# Altium schematic symbol library 74xx-eu.SCHLIB: 627 symbols (part 1 of 4)
Pins are listed as number, name and electrical type; pins without a type are passive.

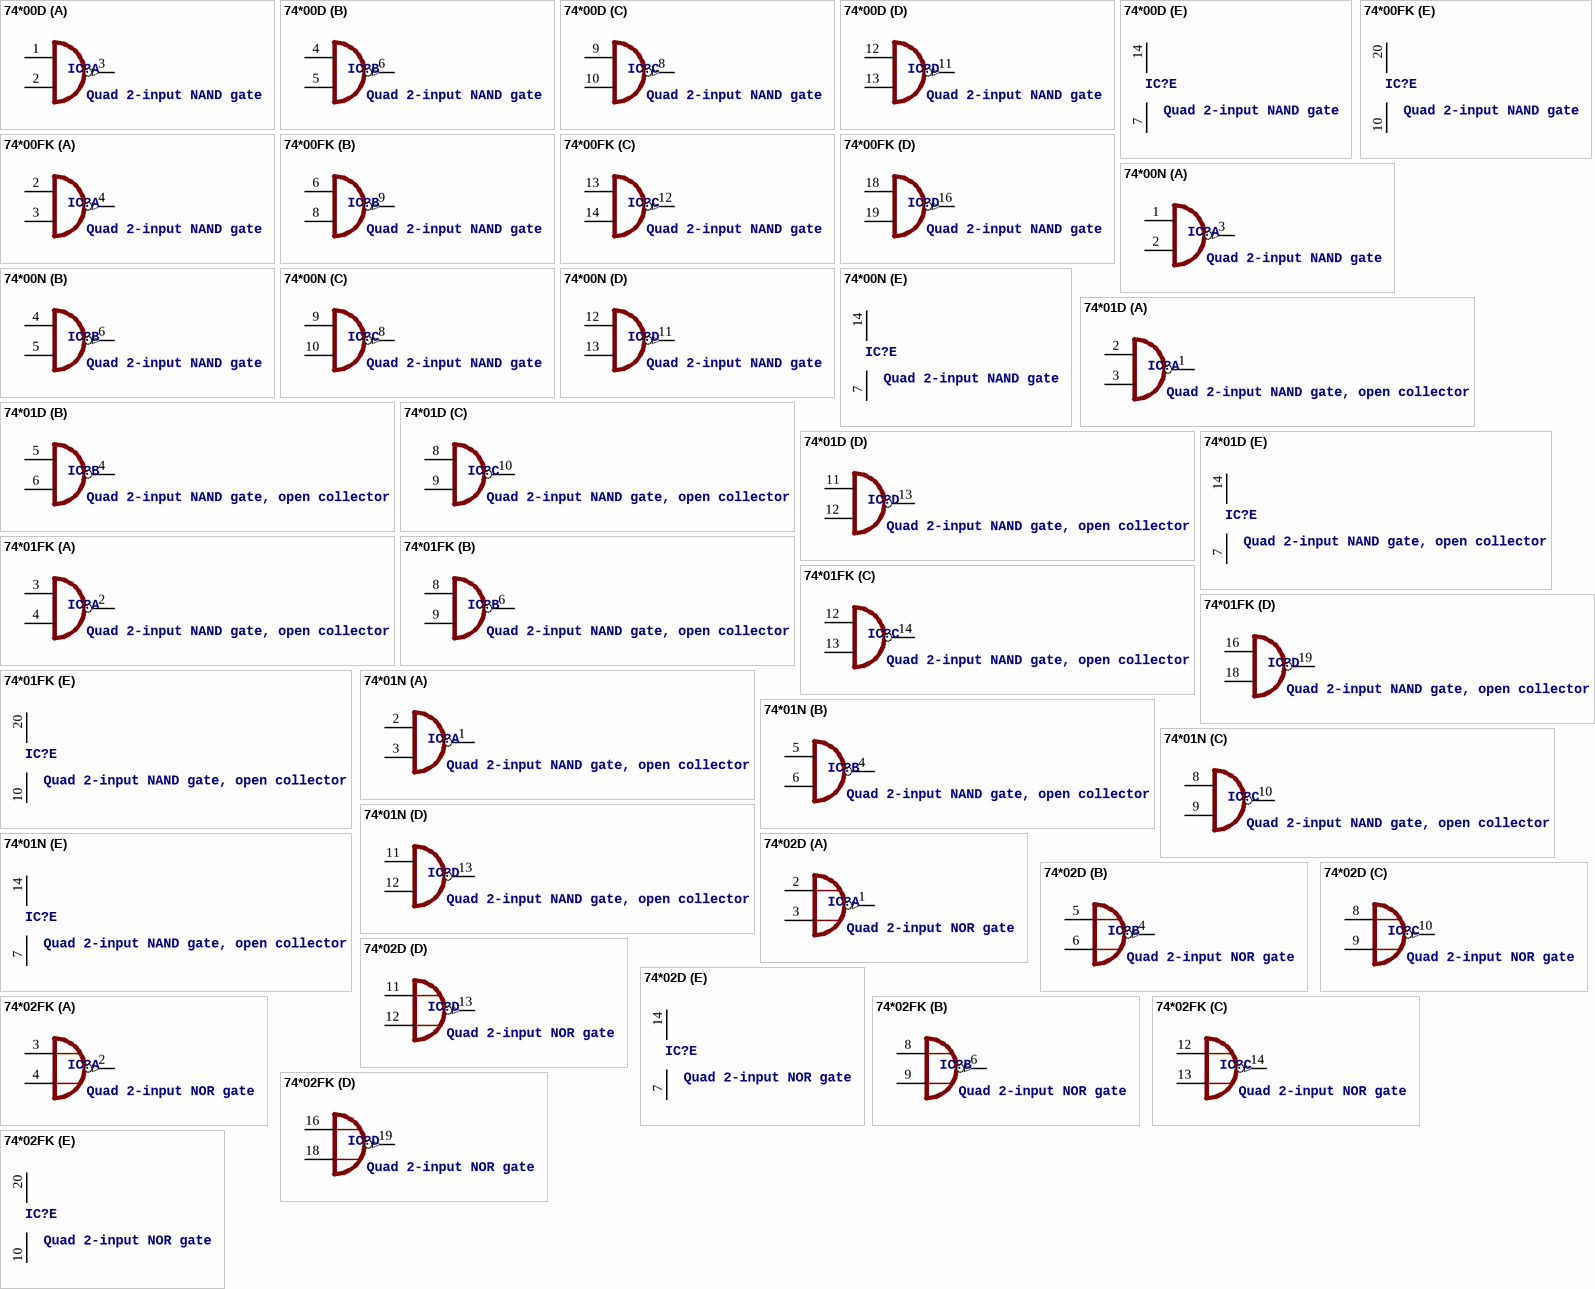
[diagram p0: symbols 74*00D to 74*02FK]

## 74*00D
designator IC?, comment Quad 2-input NAND gate
footprint SO14
part A pins: 1 I0, 2 I1, 3 O (out)
part B pins: 4 I0, 5 I1, 6 O (out)
part C pins: 8 O (out), 9 I0, 10 I1
part D pins: 11 O (out), 12 I0, 13 I1
part E pins: 7 GND (power), 14 VCC (power)

## 74*00FK
designator IC?, comment Quad 2-input NAND gate
footprint LCC20
part A pins: 2 I0, 3 I1, 4 O (out)
part B pins: 6 I0, 8 I1, 9 O (out)
part C pins: 12 O (out), 13 I0, 14 I1
part D pins: 16 O (out), 18 I0, 19 I1
part E pins: 10 GND (power), 20 VCC (power)

## 74*00N
designator IC?, comment Quad 2-input NAND gate
footprint DIL14
part A pins: 1 I0, 2 I1, 3 O (out)
part B pins: 4 I0, 5 I1, 6 O (out)
part C pins: 8 O (out), 9 I0, 10 I1
part D pins: 11 O (out), 12 I0, 13 I1
part E pins: 7 GND (power), 14 VCC (power)

## 74*01D
designator IC?, comment Quad 2-input NAND gate, open collector
footprint SO14
part A pins: 1 O (oc), 2 I0, 3 I1
part B pins: 4 O (oc), 5 I0, 6 I1
part C pins: 8 I0, 9 I1, 10 O (oc)
part D pins: 11 I0, 12 I1, 13 O (oc)
part E pins: 7 GND (power), 14 VCC (power)

## 74*01FK
designator IC?, comment Quad 2-input NAND gate, open collector
footprint LCC20
part A pins: 2 O (oc), 3 I0, 4 I1
part B pins: 6 O (oc), 8 I0, 9 I1
part C pins: 12 I0, 13 I1, 14 O (oc)
part D pins: 16 I0, 18 I1, 19 O (oc)
part E pins: 10 GND (power), 20 VCC (power)

## 74*01N
designator IC?, comment Quad 2-input NAND gate, open collector
footprint DIL14
part A pins: 1 O (oc), 2 I0, 3 I1
part B pins: 4 O (oc), 5 I0, 6 I1
part C pins: 8 I0, 9 I1, 10 O (oc)
part D pins: 11 I0, 12 I1, 13 O (oc)
part E pins: 7 GND (power), 14 VCC (power)

## 74*02D
designator IC?, comment Quad 2-input NOR gate
footprint SO14
part A pins: 1 O (out), 2 I0, 3 I1
part B pins: 4 O (out), 5 I0, 6 I1
part C pins: 8 I0, 9 I1, 10 O (out)
part D pins: 11 I0, 12 I1, 13 O (out)
part E pins: 7 GND (power), 14 VCC (power)

## 74*02FK
designator IC?, comment Quad 2-input NOR gate
footprint LCC20
part A pins: 2 O (out), 3 I0, 4 I1
part B pins: 6 O (out), 8 I0, 9 I1
part C pins: 12 I0, 13 I1, 14 O (out)
part D pins: 16 I0, 18 I1, 19 O (out)
part E pins: 10 GND (power), 20 VCC (power)

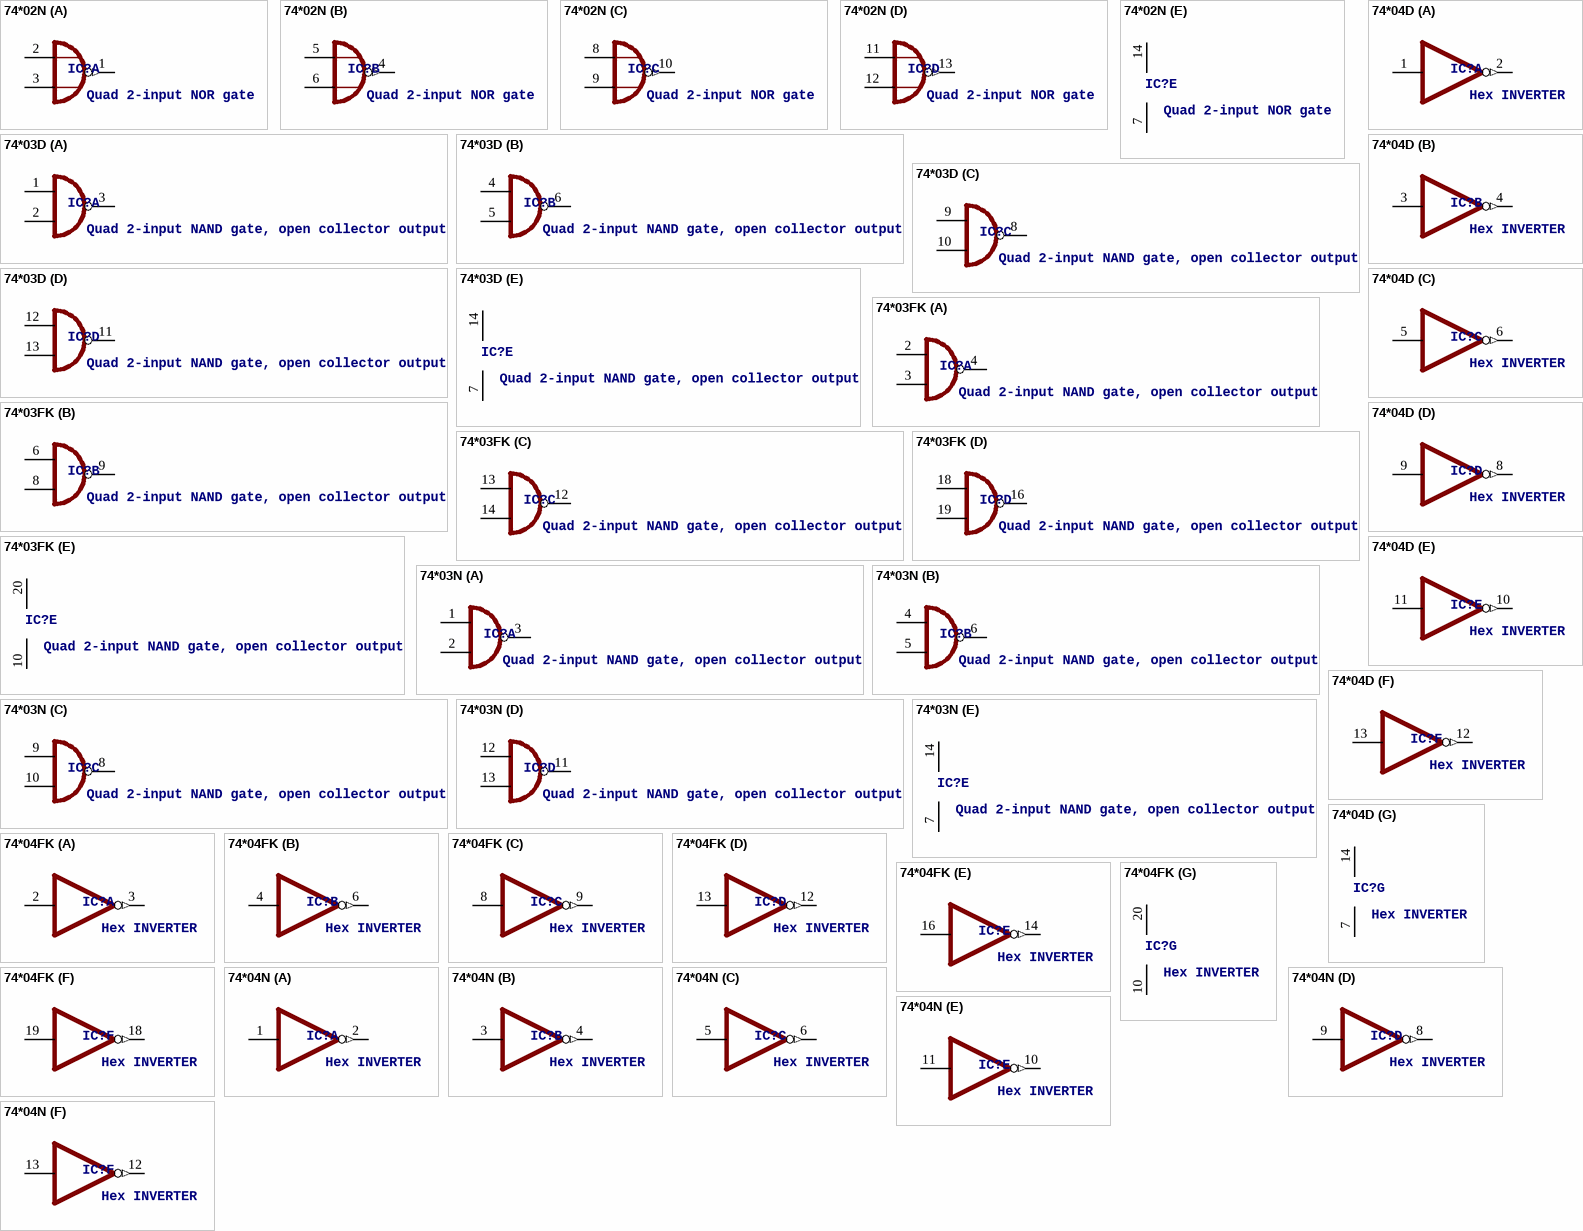
[diagram p1: symbols 74*02N to 74*04N]

## 74*02N
designator IC?, comment Quad 2-input NOR gate
footprint DIL14
part A pins: 1 O (out), 2 I0, 3 I1
part B pins: 4 O (out), 5 I0, 6 I1
part C pins: 8 I0, 9 I1, 10 O (out)
part D pins: 11 I0, 12 I1, 13 O (out)
part E pins: 7 GND (power), 14 VCC (power)

## 74*03D
designator IC?, comment Quad 2-input NAND gate, open collector output
footprint SO14
part A pins: 1 I0, 2 I1, 3 O (oc)
part B pins: 4 I0, 5 I1, 6 O (oc)
part C pins: 8 O (oc), 9 I0, 10 I1
part D pins: 11 O (oc), 12 I0, 13 I1
part E pins: 7 GND (power), 14 VCC (power)

## 74*03FK
designator IC?, comment Quad 2-input NAND gate, open collector output
footprint LCC20
part A pins: 2 I0, 3 I1, 4 O (oc)
part B pins: 6 I0, 8 I1, 9 O (oc)
part C pins: 12 O (oc), 13 I0, 14 I1
part D pins: 16 O (oc), 18 I0, 19 I1
part E pins: 10 GND (power), 20 VCC (power)

## 74*03N
designator IC?, comment Quad 2-input NAND gate, open collector output
footprint DIL14
part A pins: 1 I0, 2 I1, 3 O (oc)
part B pins: 4 I0, 5 I1, 6 O (oc)
part C pins: 8 O (oc), 9 I0, 10 I1
part D pins: 11 O (oc), 12 I0, 13 I1
part E pins: 7 GND (power), 14 VCC (power)

## 74*04D
designator IC?, comment Hex INVERTER
footprint SO14
part A pins: 1 I, 2 O (out)
part B pins: 3 I, 4 O (out)
part C pins: 5 I, 6 O (out)
part D pins: 8 O (out), 9 I
part E pins: 10 O (out), 11 I
part F pins: 12 O (out), 13 I
part G pins: 7 GND (power), 14 VCC (power)

## 74*04FK
designator IC?, comment Hex INVERTER
footprint LCC20
part A pins: 2 I, 3 O (out)
part B pins: 4 I, 6 O (out)
part C pins: 8 I, 9 O (out)
part D pins: 12 O (out), 13 I
part E pins: 14 O (out), 16 I
part F pins: 18 O (out), 19 I
part G pins: 10 GND (power), 20 VCC (power)

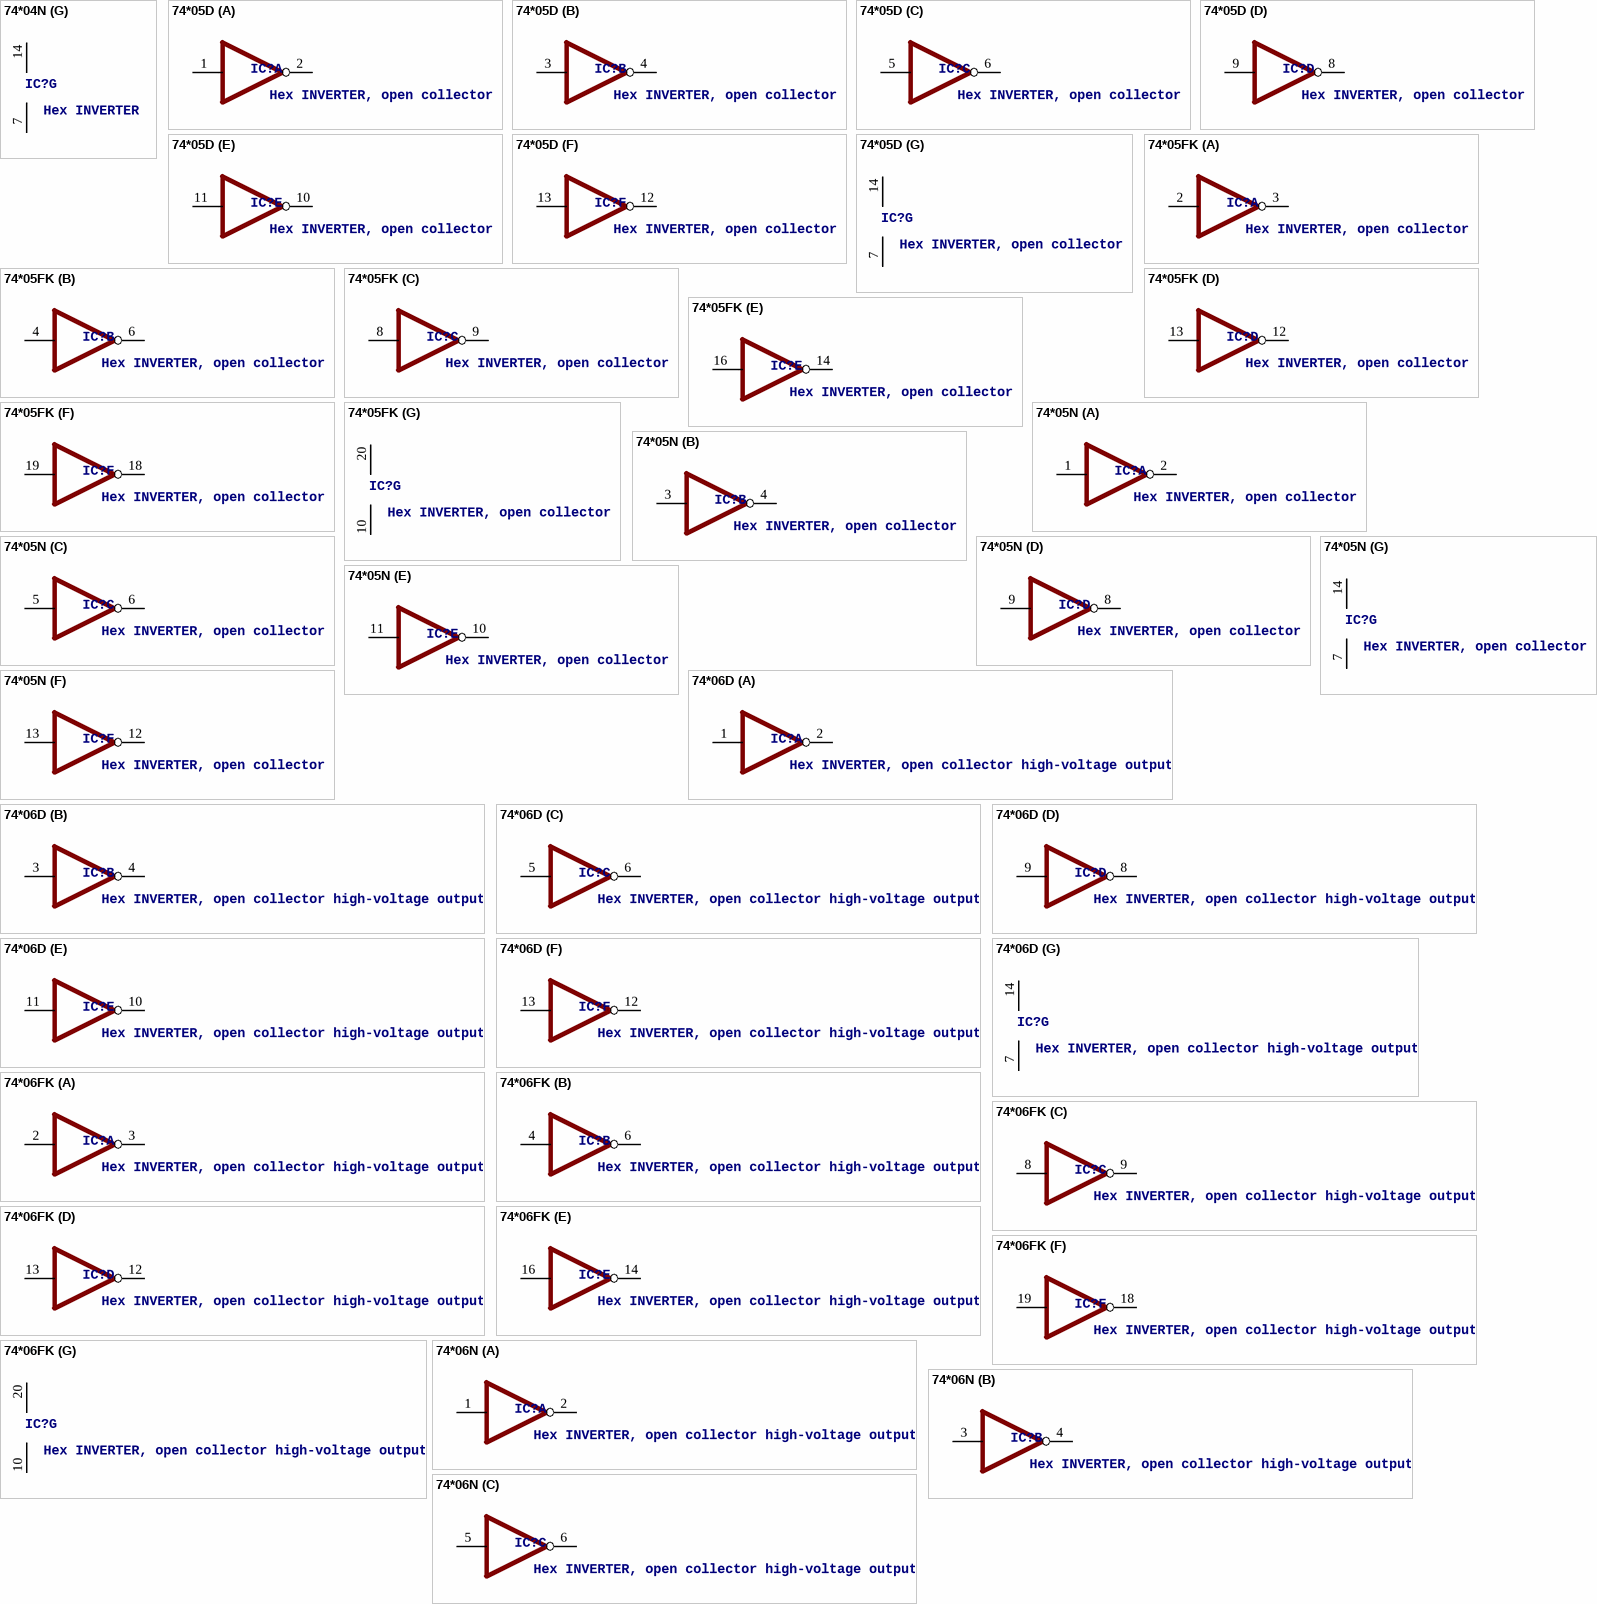
[diagram p2: symbols 74*04N to 74*06N]

## 74*04N
designator IC?, comment Hex INVERTER
footprint DIL14
part A pins: 1 I, 2 O (out)
part B pins: 3 I, 4 O (out)
part C pins: 5 I, 6 O (out)
part D pins: 8 O (out), 9 I
part E pins: 10 O (out), 11 I
part F pins: 12 O (out), 13 I
part G pins: 7 GND (power), 14 VCC (power)

## 74*05D
designator IC?, comment Hex INVERTER, open collector
footprint SO14
part A pins: 1 I, 2 O (oc)
part B pins: 3 I, 4 O (oc)
part C pins: 5 I, 6 O (oc)
part D pins: 8 O (oc), 9 I
part E pins: 10 O (oc), 11 I
part F pins: 12 O (oc), 13 I
part G pins: 7 GND (power), 14 VCC (power)

## 74*05FK
designator IC?, comment Hex INVERTER, open collector
footprint LCC20
part A pins: 2 I, 3 O (oc)
part B pins: 4 I, 6 O (oc)
part C pins: 8 I, 9 O (oc)
part D pins: 12 O (oc), 13 I
part E pins: 14 O (oc), 16 I
part F pins: 18 O (oc), 19 I
part G pins: 10 GND (power), 20 VCC (power)

## 74*05N
designator IC?, comment Hex INVERTER, open collector
footprint DIL14
part A pins: 1 I, 2 O (oc)
part B pins: 3 I, 4 O (oc)
part C pins: 5 I, 6 O (oc)
part D pins: 8 O (oc), 9 I
part E pins: 10 O (oc), 11 I
part F pins: 12 O (oc), 13 I
part G pins: 7 GND (power), 14 VCC (power)

## 74*06D
designator IC?, comment Hex INVERTER, open collector high-voltage output
footprint SO14
part A pins: 1 I, 2 O (oc)
part B pins: 3 I, 4 O (oc)
part C pins: 5 I, 6 O (oc)
part D pins: 8 O (oc), 9 I
part E pins: 10 O (oc), 11 I
part F pins: 12 O (oc), 13 I
part G pins: 7 GND (power), 14 VCC (power)

## 74*06FK
designator IC?, comment Hex INVERTER, open collector high-voltage output
footprint LCC20
part A pins: 2 I, 3 O (oc)
part B pins: 4 I, 6 O (oc)
part C pins: 8 I, 9 O (oc)
part D pins: 12 O (oc), 13 I
part E pins: 14 O (oc), 16 I
part F pins: 18 O (oc), 19 I
part G pins: 10 GND (power), 20 VCC (power)

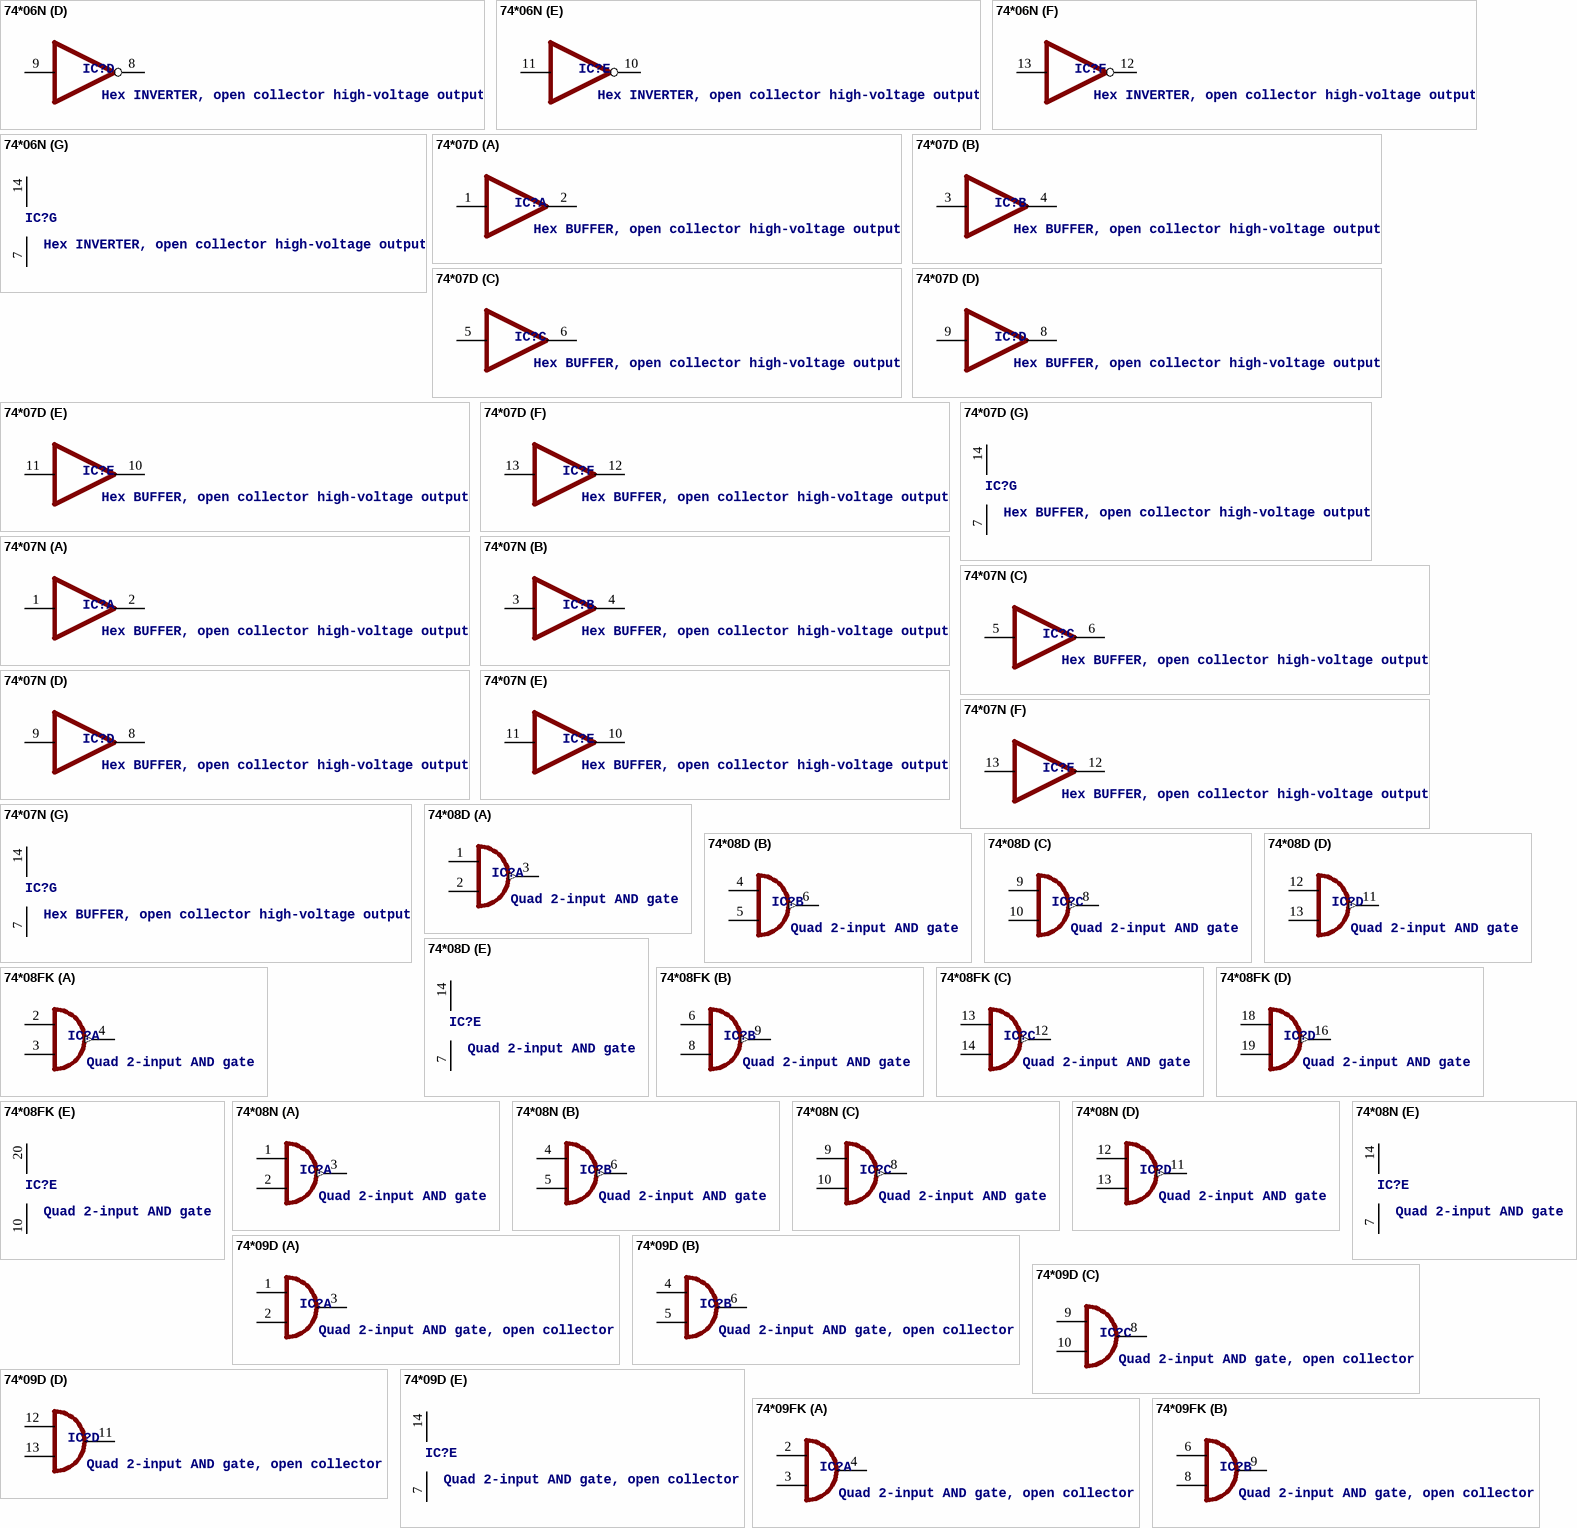
[diagram p3: symbols 74*06N to 74*09FK]

## 74*06N
designator IC?, comment Hex INVERTER, open collector high-voltage output
footprint DIL14
part A pins: 1 I, 2 O (oc)
part B pins: 3 I, 4 O (oc)
part C pins: 5 I, 6 O (oc)
part D pins: 8 O (oc), 9 I
part E pins: 10 O (oc), 11 I
part F pins: 12 O (oc), 13 I
part G pins: 7 GND (power), 14 VCC (power)

## 74*07D
designator IC?, comment Hex BUFFER, open collector high-voltage output
footprint SO14
part A pins: 1 I, 2 O (oc)
part B pins: 3 I, 4 O (oc)
part C pins: 5 I, 6 O (oc)
part D pins: 8 O (oc), 9 I
part E pins: 10 O (oc), 11 I
part F pins: 12 O (oc), 13 I
part G pins: 7 GND (power), 14 VCC (power)

## 74*07N
designator IC?, comment Hex BUFFER, open collector high-voltage output
footprint DIL14
part A pins: 1 I, 2 O (oc)
part B pins: 3 I, 4 O (oc)
part C pins: 5 I, 6 O (oc)
part D pins: 8 O (oc), 9 I
part E pins: 10 O (oc), 11 I
part F pins: 12 O (oc), 13 I
part G pins: 7 GND (power), 14 VCC (power)

## 74*08D
designator IC?, comment Quad 2-input AND gate
footprint SO14
part A pins: 1 I0, 2 I1, 3 O (out)
part B pins: 4 I0, 5 I1, 6 O (out)
part C pins: 8 O (out), 9 I0, 10 I1
part D pins: 11 O (out), 12 I0, 13 I1
part E pins: 7 GND (power), 14 VCC (power)

## 74*08FK
designator IC?, comment Quad 2-input AND gate
footprint LCC20
part A pins: 2 I0, 3 I1, 4 O (out)
part B pins: 6 I0, 8 I1, 9 O (out)
part C pins: 12 O (out), 13 I0, 14 I1
part D pins: 16 O (out), 18 I0, 19 I1
part E pins: 10 GND (power), 20 VCC (power)

## 74*08N
designator IC?, comment Quad 2-input AND gate
footprint DIL14
part A pins: 1 I0, 2 I1, 3 O (out)
part B pins: 4 I0, 5 I1, 6 O (out)
part C pins: 8 O (out), 9 I0, 10 I1
part D pins: 11 O (out), 12 I0, 13 I1
part E pins: 7 GND (power), 14 VCC (power)

## 74*09D
designator IC?, comment Quad 2-input AND gate, open collector
footprint SO14
part A pins: 1 I0, 2 I1, 3 O (oc)
part B pins: 4 I0, 5 I1, 6 O (oc)
part C pins: 8 O (oc), 9 I0, 10 I1
part D pins: 11 O (oc), 12 I0, 13 I1
part E pins: 7 GND (power), 14 VCC (power)

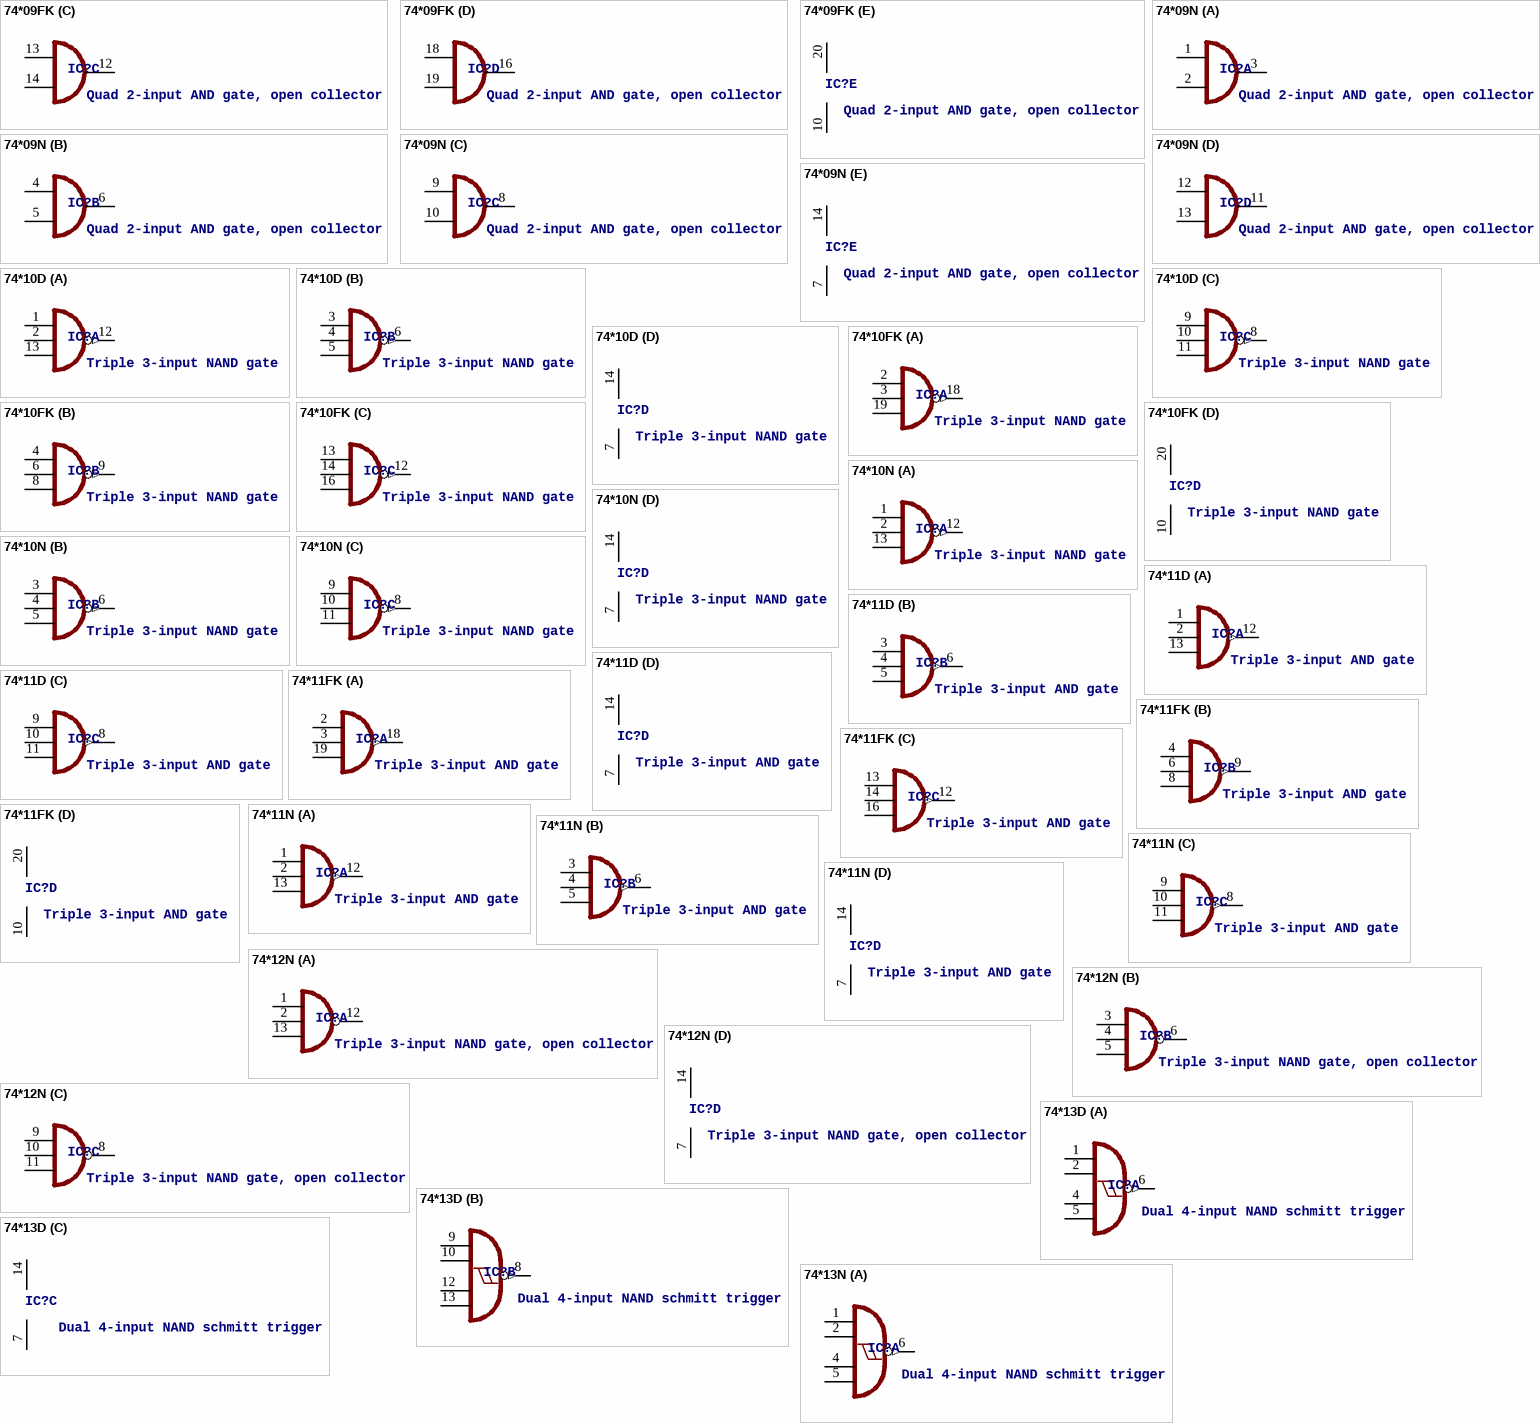
[diagram p4: symbols 74*09FK to 74*13N]

## 74*09FK
designator IC?, comment Quad 2-input AND gate, open collector
footprint LCC20
part A pins: 2 I0, 3 I1, 4 O (oc)
part B pins: 6 I0, 8 I1, 9 O (oc)
part C pins: 12 O (oc), 13 I0, 14 I1
part D pins: 16 O (oc), 18 I0, 19 I1
part E pins: 10 GND (power), 20 VCC (power)

## 74*09N
designator IC?, comment Quad 2-input AND gate, open collector
footprint DIL14
part A pins: 1 I0, 2 I1, 3 O (oc)
part B pins: 4 I0, 5 I1, 6 O (oc)
part C pins: 8 O (oc), 9 I0, 10 I1
part D pins: 11 O (oc), 12 I0, 13 I1
part E pins: 7 GND (power), 14 VCC (power)

## 74*10D
designator IC?, comment Triple 3-input NAND gate
footprint SO14
part A pins: 1 I0, 2 I1, 12 O (out), 13 I2
part B pins: 3 I0, 4 I1, 5 I2, 6 O (out)
part C pins: 8 O (out), 9 I0, 10 I1, 11 I2
part D pins: 7 GND (power), 14 VCC (power)

## 74*10FK
designator IC?, comment Triple 3-input NAND gate
footprint LCC20
part A pins: 2 I0, 3 I1, 18 O (out), 19 I2
part B pins: 4 I0, 6 I1, 8 I2, 9 O (out)
part C pins: 12 O (out), 13 I0, 14 I1, 16 I2
part D pins: 10 GND (power), 20 VCC (power)

## 74*10N
designator IC?, comment Triple 3-input NAND gate
footprint DIL14
part A pins: 1 I0, 2 I1, 12 O (out), 13 I2
part B pins: 3 I0, 4 I1, 5 I2, 6 O (out)
part C pins: 8 O (out), 9 I0, 10 I1, 11 I2
part D pins: 7 GND (power), 14 VCC (power)

## 74*11D
designator IC?, comment Triple 3-input AND gate
footprint SO14
part A pins: 1 I0, 2 I1, 12 O (out), 13 I2
part B pins: 3 I0, 4 I1, 5 I2, 6 O (out)
part C pins: 8 O (out), 9 I0, 10 I1, 11 I2
part D pins: 7 GND (power), 14 VCC (power)

## 74*11FK
designator IC?, comment Triple 3-input AND gate
footprint LCC20
part A pins: 2 I0, 3 I1, 18 O (out), 19 I2
part B pins: 4 I0, 6 I1, 8 I2, 9 O (out)
part C pins: 12 O (out), 13 I0, 14 I1, 16 I2
part D pins: 10 GND (power), 20 VCC (power)

## 74*11N
designator IC?, comment Triple 3-input AND gate
footprint DIL14
part A pins: 1 I0, 2 I1, 12 O (out), 13 I2
part B pins: 3 I0, 4 I1, 5 I2, 6 O (out)
part C pins: 8 O (out), 9 I0, 10 I1, 11 I2
part D pins: 7 GND (power), 14 VCC (power)

## 74*12N
designator IC?, comment Triple 3-input NAND gate, open collector
footprint DIL14
part A pins: 1 I0, 2 I1, 12 O (oc), 13 I2
part B pins: 3 I0, 4 I1, 5 I2, 6 O (oc)
part C pins: 8 O (oc), 9 I0, 10 I1, 11 I2
part D pins: 7 GND (power), 14 VCC (power)

## 74*13D
designator IC?, comment Dual 4-input NAND schmitt trigger
footprint SO14
part A pins: 1 I0, 2 I1, 4 I2, 5 I3, 6 O (out)
part B pins: 8 O (out), 9 I0, 10 I1, 12 I2, 13 I3
part C pins: 7 GND (power), 14 VCC (power)

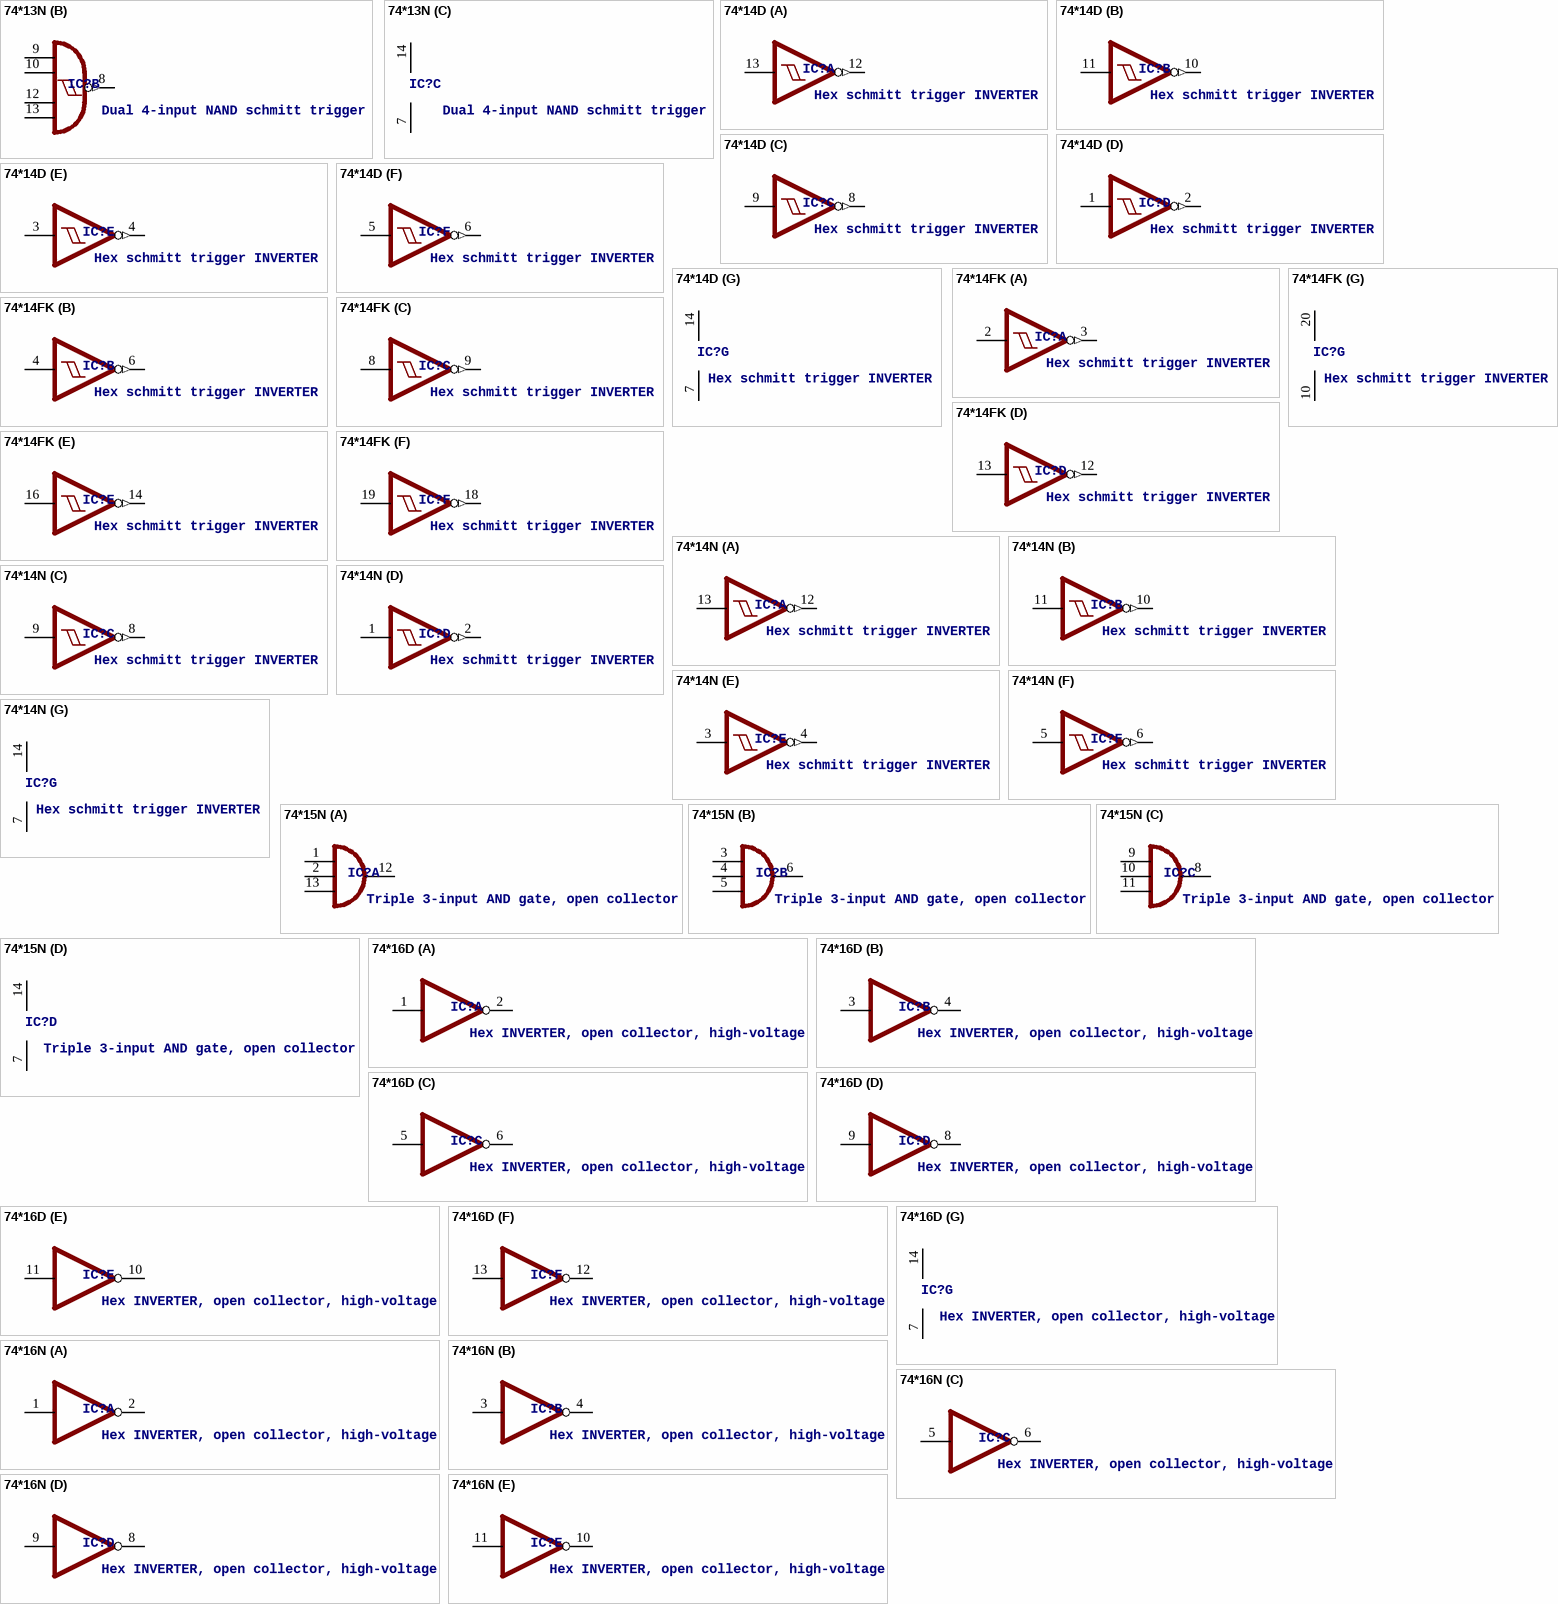
[diagram p5: symbols 74*13N to 74*16N]

## 74*13N
designator IC?, comment Dual 4-input NAND schmitt trigger
footprint DIL14
part A pins: 1 I0, 2 I1, 4 I2, 5 I3, 6 O (out)
part B pins: 8 O (out), 9 I0, 10 I1, 12 I2, 13 I3
part C pins: 7 GND (power), 14 VCC (power)

## 74*14D
designator IC?, comment Hex schmitt trigger INVERTER
footprint SO14
part A pins: 12 O (out), 13 I
part B pins: 10 O (out), 11 I
part C pins: 8 O (out), 9 I
part D pins: 1 I, 2 O (out)
part E pins: 3 I, 4 O (out)
part F pins: 5 I, 6 O (out)
part G pins: 7 GND (power), 14 VCC (power)

## 74*14FK
designator IC?, comment Hex schmitt trigger INVERTER
footprint LCC20
part A pins: 2 I, 3 O (out)
part B pins: 4 I, 6 O (out)
part C pins: 8 I, 9 O (out)
part D pins: 12 O (out), 13 I
part E pins: 14 O (out), 16 I
part F pins: 18 O (out), 19 I
part G pins: 10 GND (power), 20 VCC (power)

## 74*14N
designator IC?, comment Hex schmitt trigger INVERTER
footprint DIL14
part A pins: 12 O (out), 13 I
part B pins: 10 O (out), 11 I
part C pins: 8 O (out), 9 I
part D pins: 1 I, 2 O (out)
part E pins: 3 I, 4 O (out)
part F pins: 5 I, 6 O (out)
part G pins: 7 GND (power), 14 VCC (power)

## 74*15N
designator IC?, comment Triple 3-input AND gate, open collector
footprint DIL14
part A pins: 1 I0, 2 I1, 12 O (oc), 13 I2
part B pins: 3 I0, 4 I1, 5 I2, 6 O (oc)
part C pins: 8 O (oc), 9 I0, 10 I1, 11 I2
part D pins: 7 GND (power), 14 VCC (power)

## 74*16D
designator IC?, comment Hex INVERTER, open collector, high-voltage
footprint SO14
part A pins: 1 I, 2 O (oc)
part B pins: 3 I, 4 O (oc)
part C pins: 5 I, 6 O (oc)
part D pins: 8 O (oc), 9 I
part E pins: 10 O (oc), 11 I
part F pins: 12 O (oc), 13 I
part G pins: 7 GND (power), 14 VCC (power)

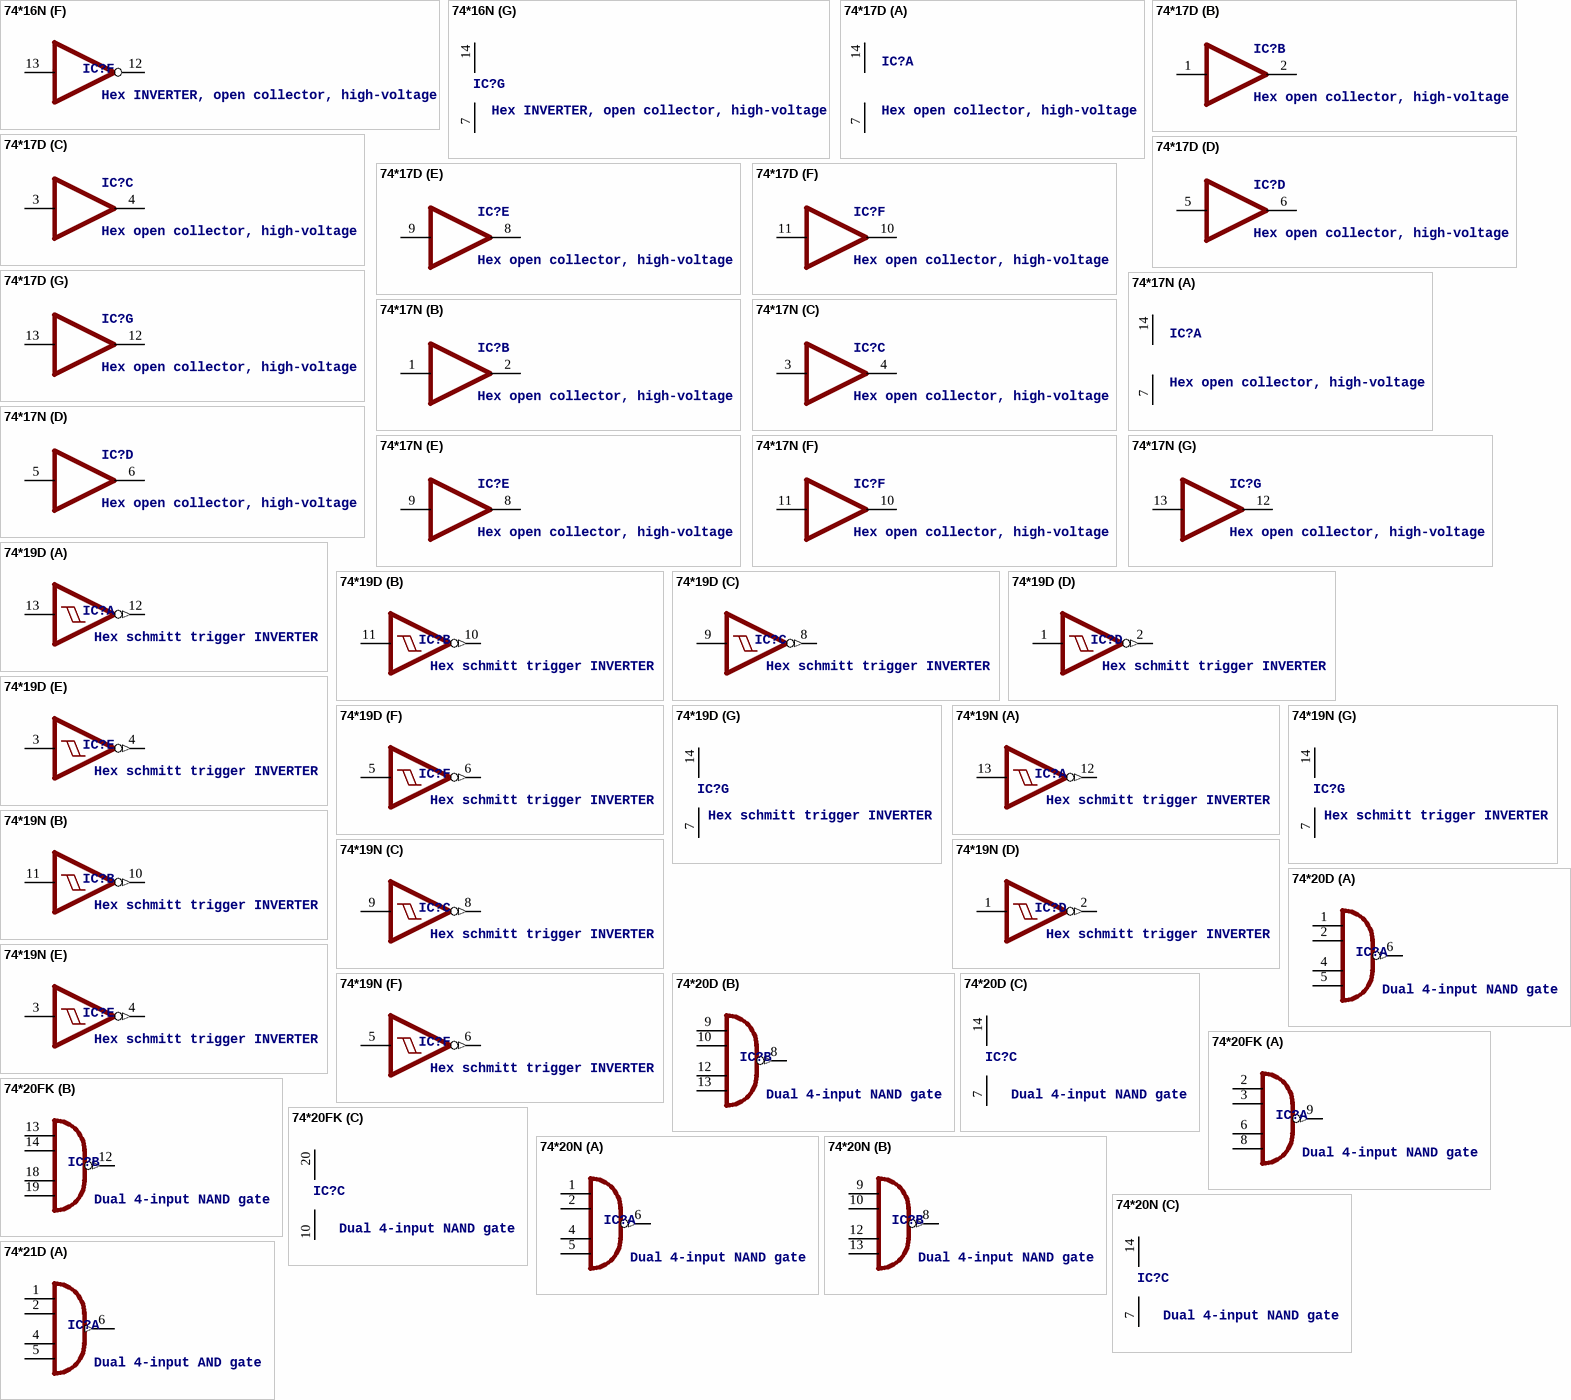
[diagram p6: symbols 74*16N to 74*21D]

## 74*16N
designator IC?, comment Hex INVERTER, open collector, high-voltage
footprint DIL14
part A pins: 1 I, 2 O (oc)
part B pins: 3 I, 4 O (oc)
part C pins: 5 I, 6 O (oc)
part D pins: 8 O (oc), 9 I
part E pins: 10 O (oc), 11 I
part F pins: 12 O (oc), 13 I
part G pins: 7 GND (power), 14 VCC (power)

## 74*17D
designator IC?, comment Hex open collector, high-voltage
footprint SO14
part A pins: 7 GND (power), 14 VCC (power)
part B pins: 1 I, 2 O (oc)
part C pins: 3 I, 4 O (oc)
part D pins: 5 I, 6 O (oc)
part E pins: 8 O (oc), 9 I
part F pins: 10 O (oc), 11 I
part G pins: 12 O (oc), 13 I

## 74*17N
designator IC?, comment Hex open collector, high-voltage
footprint DIL14
part A pins: 7 GND (power), 14 VCC (power)
part B pins: 1 I, 2 O (oc)
part C pins: 3 I, 4 O (oc)
part D pins: 5 I, 6 O (oc)
part E pins: 8 O (oc), 9 I
part F pins: 10 O (oc), 11 I
part G pins: 12 O (oc), 13 I

## 74*19D
designator IC?, comment Hex schmitt trigger INVERTER
footprint SO14
part A pins: 12 O (out), 13 I
part B pins: 10 O (out), 11 I
part C pins: 8 O (out), 9 I
part D pins: 1 I, 2 O (out)
part E pins: 3 I, 4 O (out)
part F pins: 5 I, 6 O (out)
part G pins: 7 GND (power), 14 VCC (power)

## 74*19N
designator IC?, comment Hex schmitt trigger INVERTER
footprint DIL14
part A pins: 12 O (out), 13 I
part B pins: 10 O (out), 11 I
part C pins: 8 O (out), 9 I
part D pins: 1 I, 2 O (out)
part E pins: 3 I, 4 O (out)
part F pins: 5 I, 6 O (out)
part G pins: 7 GND (power), 14 VCC (power)

## 74*20D
designator IC?, comment Dual 4-input NAND gate
footprint SO14
part A pins: 1 I0, 2 I1, 4 I2, 5 I3, 6 O (out)
part B pins: 8 O (out), 9 I0, 10 I1, 12 I2, 13 I3
part C pins: 7 GND (power), 14 VCC (power)

## 74*20FK
designator IC?, comment Dual 4-input NAND gate
footprint LCC20
part A pins: 2 I0, 3 I1, 6 I2, 8 I3, 9 O (out)
part B pins: 12 O (out), 13 I0, 14 I1, 18 I2, 19 I3
part C pins: 10 GND (power), 20 VCC (power)

## 74*20N
designator IC?, comment Dual 4-input NAND gate
footprint DIL14
part A pins: 1 I0, 2 I1, 4 I2, 5 I3, 6 O (out)
part B pins: 8 O (out), 9 I0, 10 I1, 12 I2, 13 I3
part C pins: 7 GND (power), 14 VCC (power)

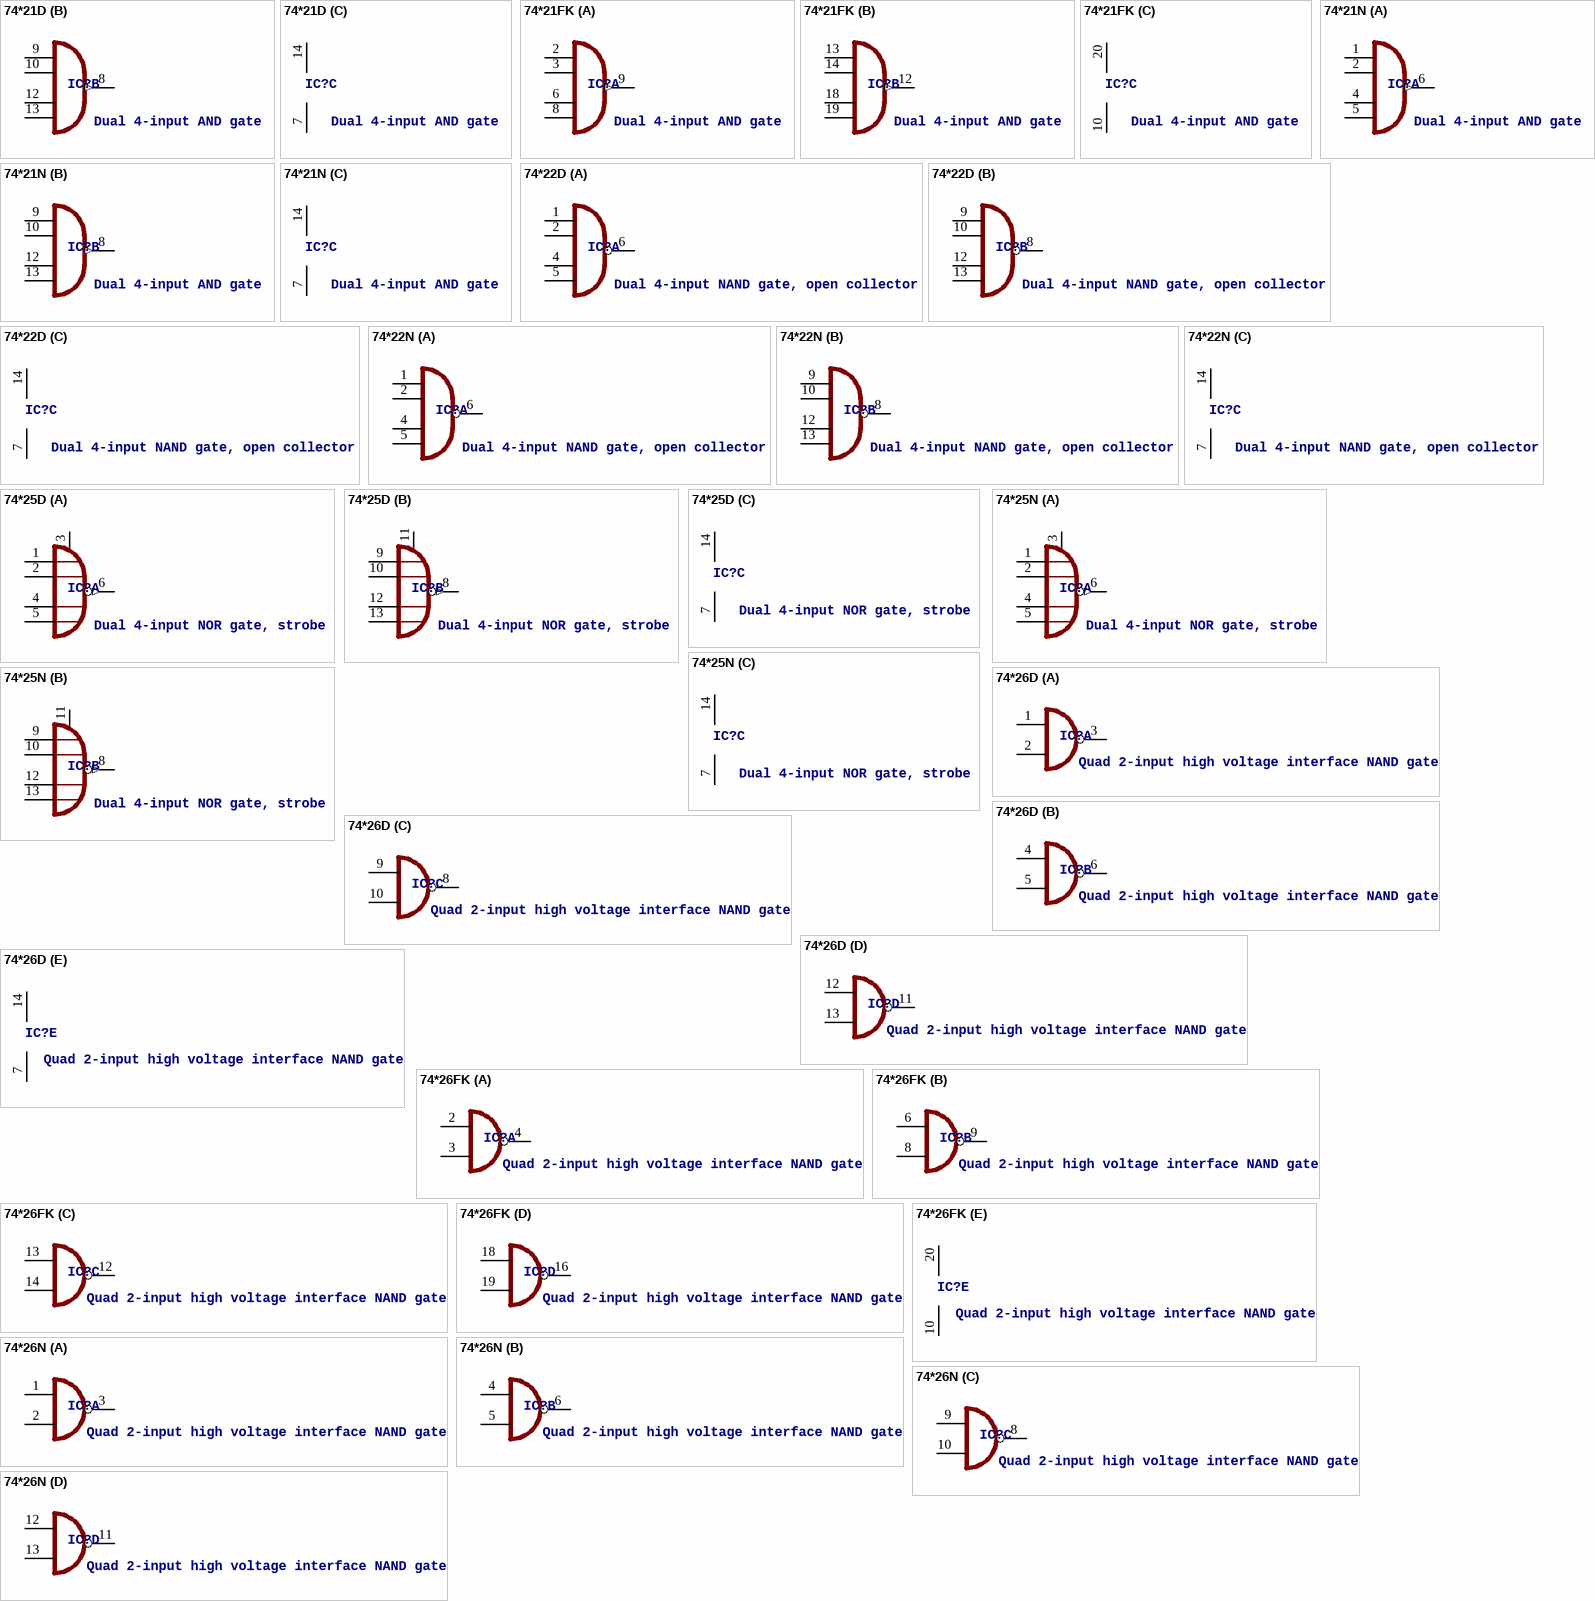
[diagram p7: symbols 74*21D to 74*26N]

## 74*21D
designator IC?, comment Dual 4-input AND gate
footprint SO14
part A pins: 1 I0, 2 I1, 4 I2, 5 I3, 6 O (out)
part B pins: 8 O (out), 9 I0, 10 I1, 12 I2, 13 I3
part C pins: 7 GND (power), 14 VCC (power)

## 74*21FK
designator IC?, comment Dual 4-input AND gate
footprint LCC20
part A pins: 2 I0, 3 I1, 6 I2, 8 I3, 9 O (out)
part B pins: 12 O (out), 13 I0, 14 I1, 18 I2, 19 I3
part C pins: 10 GND (power), 20 VCC (power)

## 74*21N
designator IC?, comment Dual 4-input AND gate
footprint DIL14
part A pins: 1 I0, 2 I1, 4 I2, 5 I3, 6 O (out)
part B pins: 8 O (out), 9 I0, 10 I1, 12 I2, 13 I3
part C pins: 7 GND (power), 14 VCC (power)

## 74*22D
designator IC?, comment Dual 4-input NAND gate, open collector
footprint SO14
part A pins: 1 I0, 2 I1, 4 I2, 5 I3, 6 O (oc)
part B pins: 8 O (oc), 9 I0, 10 I1, 12 I2, 13 I3
part C pins: 7 GND (power), 14 VCC (power)

## 74*22N
designator IC?, comment Dual 4-input NAND gate, open collector
footprint DIL14
part A pins: 1 I0, 2 I1, 4 I2, 5 I3, 6 O (oc)
part B pins: 8 O (oc), 9 I0, 10 I1, 12 I2, 13 I3
part C pins: 7 GND (power), 14 VCC (power)

## 74*25D
designator IC?, comment Dual 4-input NOR gate, strobe
footprint SO14
part A pins: 1 I0, 2 I1, 3 G, 4 I2, 5 I3, 6 O (out)
part B pins: 8 O (out), 9 I0, 10 I1, 11 G, 12 I2, 13 I3
part C pins: 7 GND (power), 14 VCC (power)

## 74*25N
designator IC?, comment Dual 4-input NOR gate, strobe
footprint DIL14
part A pins: 1 I0, 2 I1, 3 G, 4 I2, 5 I3, 6 O (out)
part B pins: 8 O (out), 9 I0, 10 I1, 11 G, 12 I2, 13 I3
part C pins: 7 GND (power), 14 VCC (power)

## 74*26D
designator IC?, comment Quad 2-input high voltage interface NAND gate
footprint SO14
part A pins: 1 I0, 2 I1, 3 O (oc)
part B pins: 4 I0, 5 I1, 6 O (oc)
part C pins: 8 O (oc), 9 I0, 10 I1
part D pins: 11 O (oc), 12 I0, 13 I1
part E pins: 7 GND (power), 14 VCC (power)

## 74*26FK
designator IC?, comment Quad 2-input high voltage interface NAND gate
footprint LCC20
part A pins: 2 I0, 3 I1, 4 O (oc)
part B pins: 6 I0, 8 I1, 9 O (oc)
part C pins: 12 O (oc), 13 I0, 14 I1
part D pins: 16 O (oc), 18 I0, 19 I1
part E pins: 10 GND (power), 20 VCC (power)

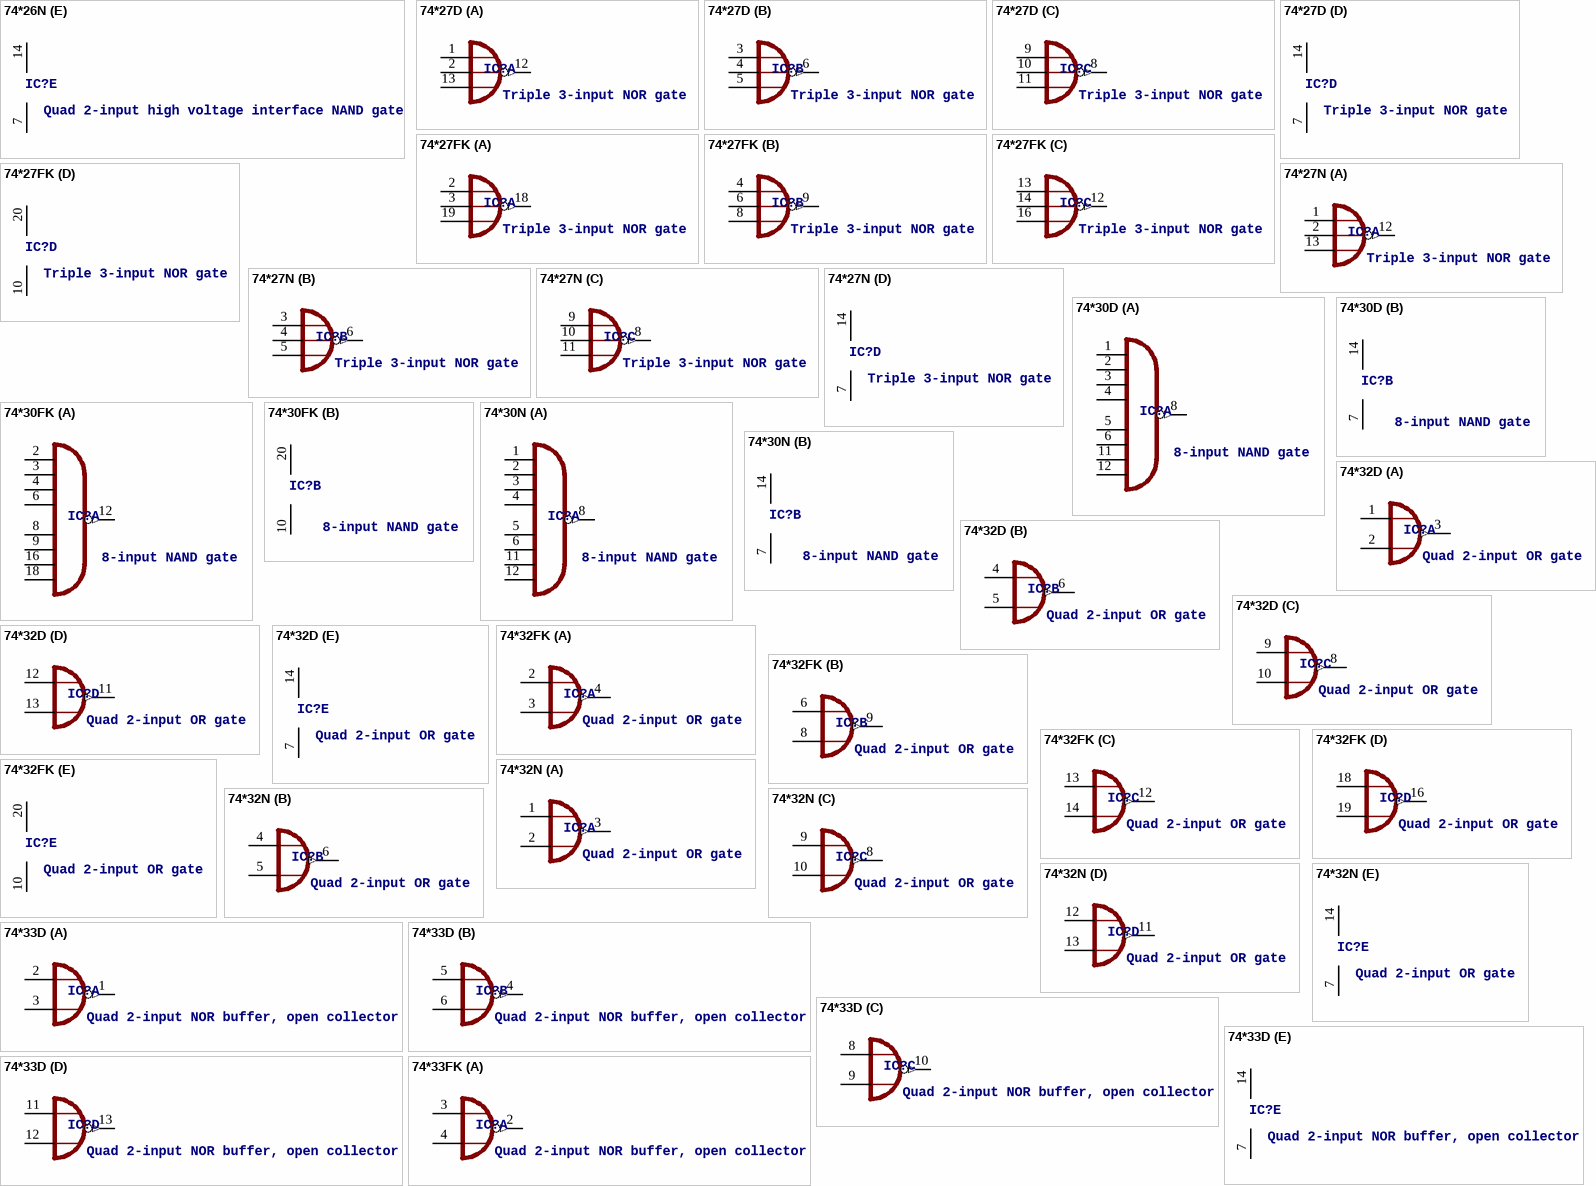
[diagram p8: symbols 74*26N to 74*33FK]

## 74*26N
designator IC?, comment Quad 2-input high voltage interface NAND gate
footprint DIL14
part A pins: 1 I0, 2 I1, 3 O (oc)
part B pins: 4 I0, 5 I1, 6 O (oc)
part C pins: 8 O (oc), 9 I0, 10 I1
part D pins: 11 O (oc), 12 I0, 13 I1
part E pins: 7 GND (power), 14 VCC (power)

## 74*27D
designator IC?, comment Triple 3-input NOR gate
footprint SO14
part A pins: 1 I0, 2 I1, 12 O (out), 13 I2
part B pins: 3 I0, 4 I1, 5 I2, 6 O (out)
part C pins: 8 O (out), 9 I0, 10 I1, 11 I2
part D pins: 7 GND (power), 14 VCC (power)

## 74*27FK
designator IC?, comment Triple 3-input NOR gate
footprint LCC20
part A pins: 2 I0, 3 I1, 18 O (out), 19 I2
part B pins: 4 I0, 6 I1, 8 I2, 9 O (out)
part C pins: 12 O (out), 13 I0, 14 I1, 16 I2
part D pins: 10 GND (power), 20 VCC (power)

## 74*27N
designator IC?, comment Triple 3-input NOR gate
footprint DIL14
part A pins: 1 I0, 2 I1, 12 O (out), 13 I2
part B pins: 3 I0, 4 I1, 5 I2, 6 O (out)
part C pins: 8 O (out), 9 I0, 10 I1, 11 I2
part D pins: 7 GND (power), 14 VCC (power)

## 74*30D
designator IC?, comment 8-input NAND gate
footprint SO14
part A pins: 1 I0, 2 I1, 3 I2, 4 I3, 5 I4, 6 I5, 8 O (out), 11 I6, 12 I7
part B pins: 7 GND (power), 14 VCC (power)

## 74*30FK
designator IC?, comment 8-input NAND gate
footprint LCC20
part A pins: 2 I0, 3 I1, 4 I2, 6 I3, 8 I4, 9 I5, 12 O (out), 16 I6, 18 I7
part B pins: 10 GND (power), 20 VCC (power)

## 74*30N
designator IC?, comment 8-input NAND gate
footprint DIL14
part A pins: 1 I0, 2 I1, 3 I2, 4 I3, 5 I4, 6 I5, 8 O (out), 11 I6, 12 I7
part B pins: 7 GND (power), 14 VCC (power)

## 74*32D
designator IC?, comment Quad 2-input OR gate
footprint SO14
part A pins: 1 I0, 2 I1, 3 O (out)
part B pins: 4 I0, 5 I1, 6 O (out)
part C pins: 8 O (out), 9 I0, 10 I1
part D pins: 11 O (out), 12 I0, 13 I1
part E pins: 7 GND (power), 14 VCC (power)

## 74*32FK
designator IC?, comment Quad 2-input OR gate
footprint LCC20
part A pins: 2 I0, 3 I1, 4 O (out)
part B pins: 6 I0, 8 I1, 9 O (out)
part C pins: 12 O (out), 13 I0, 14 I1
part D pins: 16 O (out), 18 I0, 19 I1
part E pins: 10 GND (power), 20 VCC (power)

## 74*32N
designator IC?, comment Quad 2-input OR gate
footprint DIL14
part A pins: 1 I0, 2 I1, 3 O (out)
part B pins: 4 I0, 5 I1, 6 O (out)
part C pins: 8 O (out), 9 I0, 10 I1
part D pins: 11 O (out), 12 I0, 13 I1
part E pins: 7 GND (power), 14 VCC (power)

## 74*33D
designator IC?, comment Quad 2-input NOR buffer, open collector
footprint SO14
part A pins: 1 O (out), 2 I0, 3 I1
part B pins: 4 O (out), 5 I0, 6 I1
part C pins: 8 I0, 9 I1, 10 O (out)
part D pins: 11 I0, 12 I1, 13 O (out)
part E pins: 7 GND (power), 14 VCC (power)

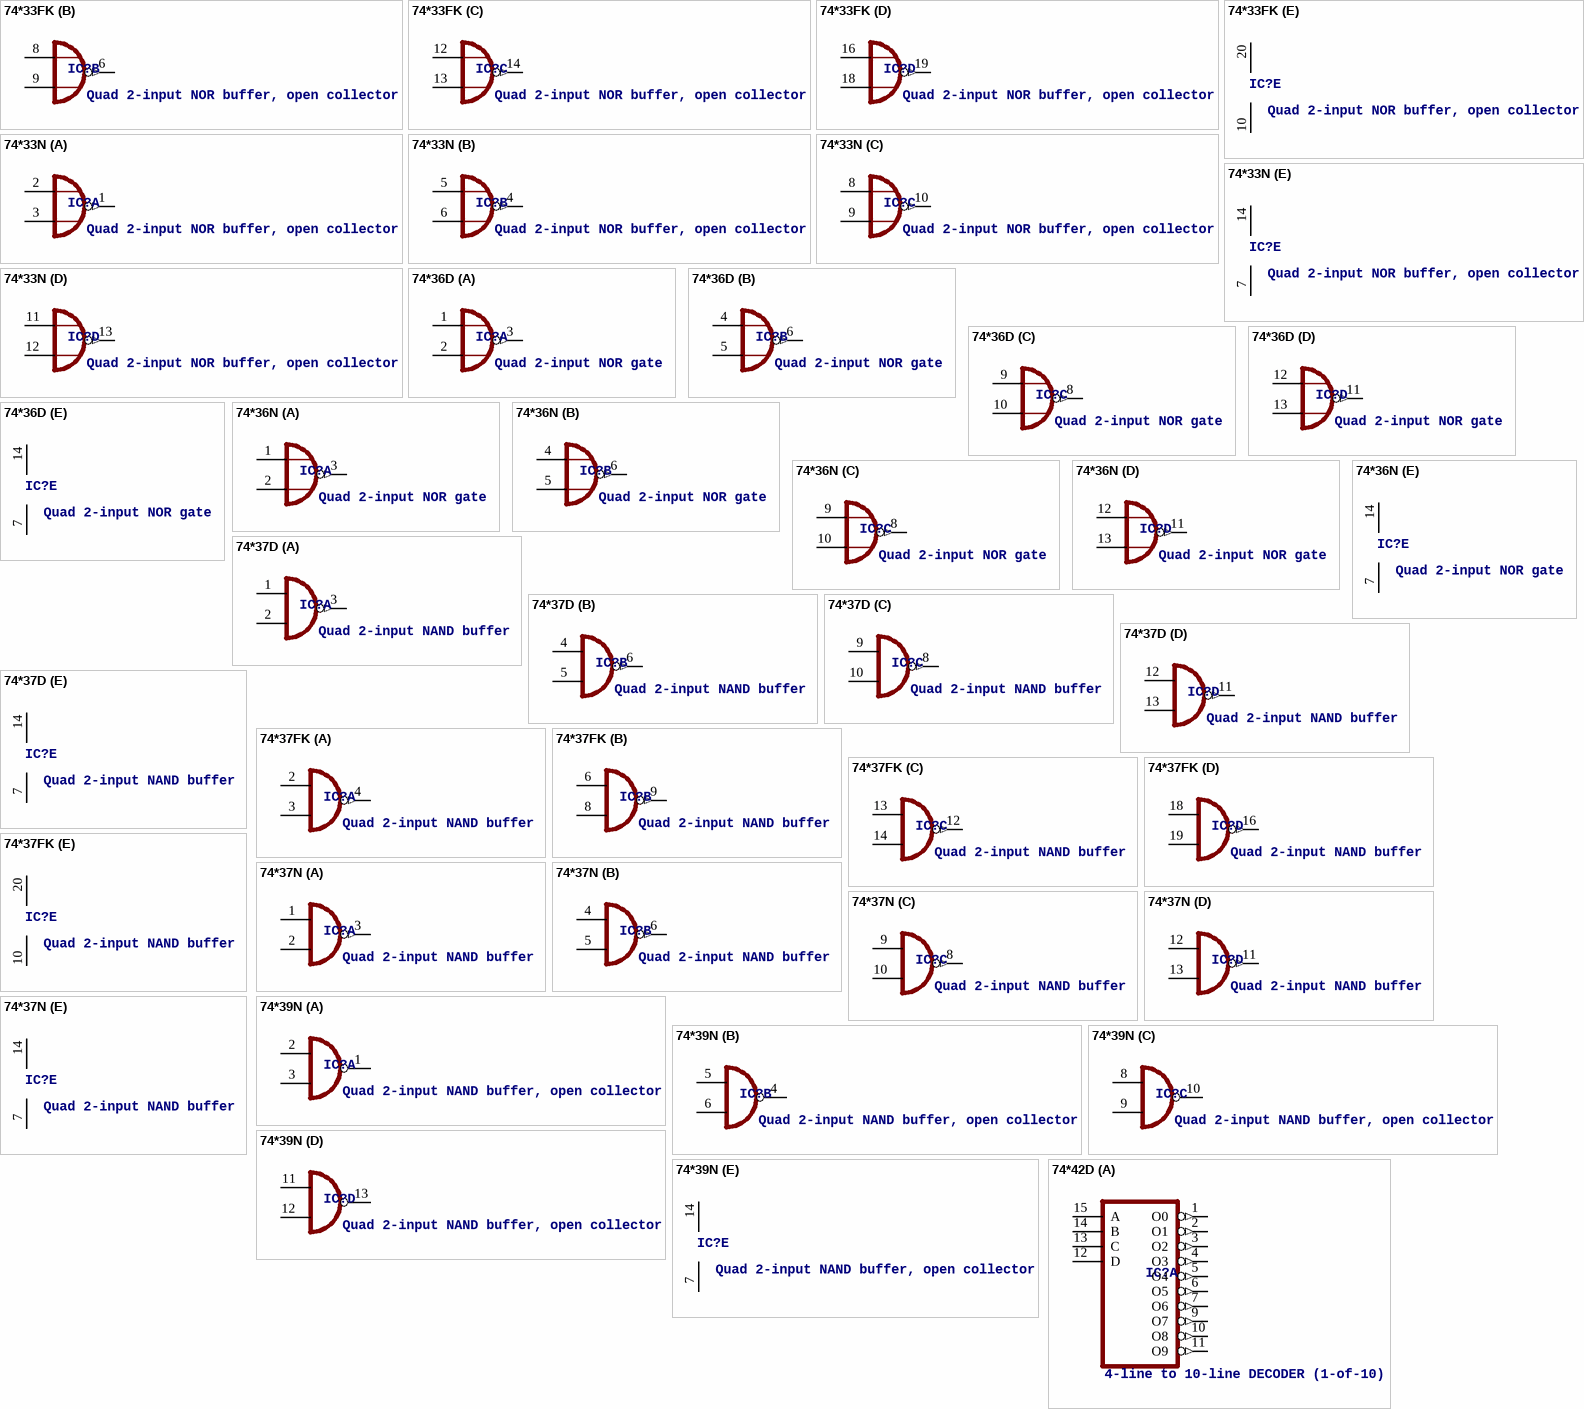
[diagram p9: symbols 74*33FK to 74*42D]

## 74*33FK
designator IC?, comment Quad 2-input NOR buffer, open collector
footprint LCC20
part A pins: 2 O (out), 3 I0, 4 I1
part B pins: 6 O (out), 8 I0, 9 I1
part C pins: 12 I0, 13 I1, 14 O (out)
part D pins: 16 I0, 18 I1, 19 O (out)
part E pins: 10 GND (power), 20 VCC (power)

## 74*33N
designator IC?, comment Quad 2-input NOR buffer, open collector
footprint DIL14
part A pins: 1 O (out), 2 I0, 3 I1
part B pins: 4 O (out), 5 I0, 6 I1
part C pins: 8 I0, 9 I1, 10 O (out)
part D pins: 11 I0, 12 I1, 13 O (out)
part E pins: 7 GND (power), 14 VCC (power)

## 74*36D
designator IC?, comment Quad 2-input NOR gate
footprint SO14
part A pins: 1 I0, 2 I1, 3 O (out)
part B pins: 4 I0, 5 I1, 6 O (out)
part C pins: 8 O (out), 9 I0, 10 I1
part D pins: 11 O (out), 12 I0, 13 I1
part E pins: 7 GND (power), 14 VCC (power)

## 74*36N
designator IC?, comment Quad 2-input NOR gate
footprint DIL14
part A pins: 1 I0, 2 I1, 3 O (out)
part B pins: 4 I0, 5 I1, 6 O (out)
part C pins: 8 O (out), 9 I0, 10 I1
part D pins: 11 O (out), 12 I0, 13 I1
part E pins: 7 GND (power), 14 VCC (power)

## 74*37D
designator IC?, comment Quad 2-input NAND buffer
footprint SO14
part A pins: 1 I0, 2 I1, 3 O (out)
part B pins: 4 I0, 5 I1, 6 O (out)
part C pins: 8 O (out), 9 I0, 10 I1
part D pins: 11 O (out), 12 I0, 13 I1
part E pins: 7 GND (power), 14 VCC (power)

## 74*37FK
designator IC?, comment Quad 2-input NAND buffer
footprint LCC20
part A pins: 2 I0, 3 I1, 4 O (out)
part B pins: 6 I0, 8 I1, 9 O (out)
part C pins: 12 O (out), 13 I0, 14 I1
part D pins: 16 O (out), 18 I0, 19 I1
part E pins: 10 GND (power), 20 VCC (power)

## 74*37N
designator IC?, comment Quad 2-input NAND buffer
footprint DIL14
part A pins: 1 I0, 2 I1, 3 O (out)
part B pins: 4 I0, 5 I1, 6 O (out)
part C pins: 8 O (out), 9 I0, 10 I1
part D pins: 11 O (out), 12 I0, 13 I1
part E pins: 7 GND (power), 14 VCC (power)

## 74*39N
designator IC?, comment Quad 2-input NAND buffer, open collector
footprint DIL14
part A pins: 1 O (oc), 2 I0, 3 I1
part B pins: 4 O (oc), 5 I0, 6 I1
part C pins: 8 I0, 9 I1, 10 O (oc)
part D pins: 11 I0, 12 I1, 13 O (oc)
part E pins: 7 GND (power), 14 VCC (power)

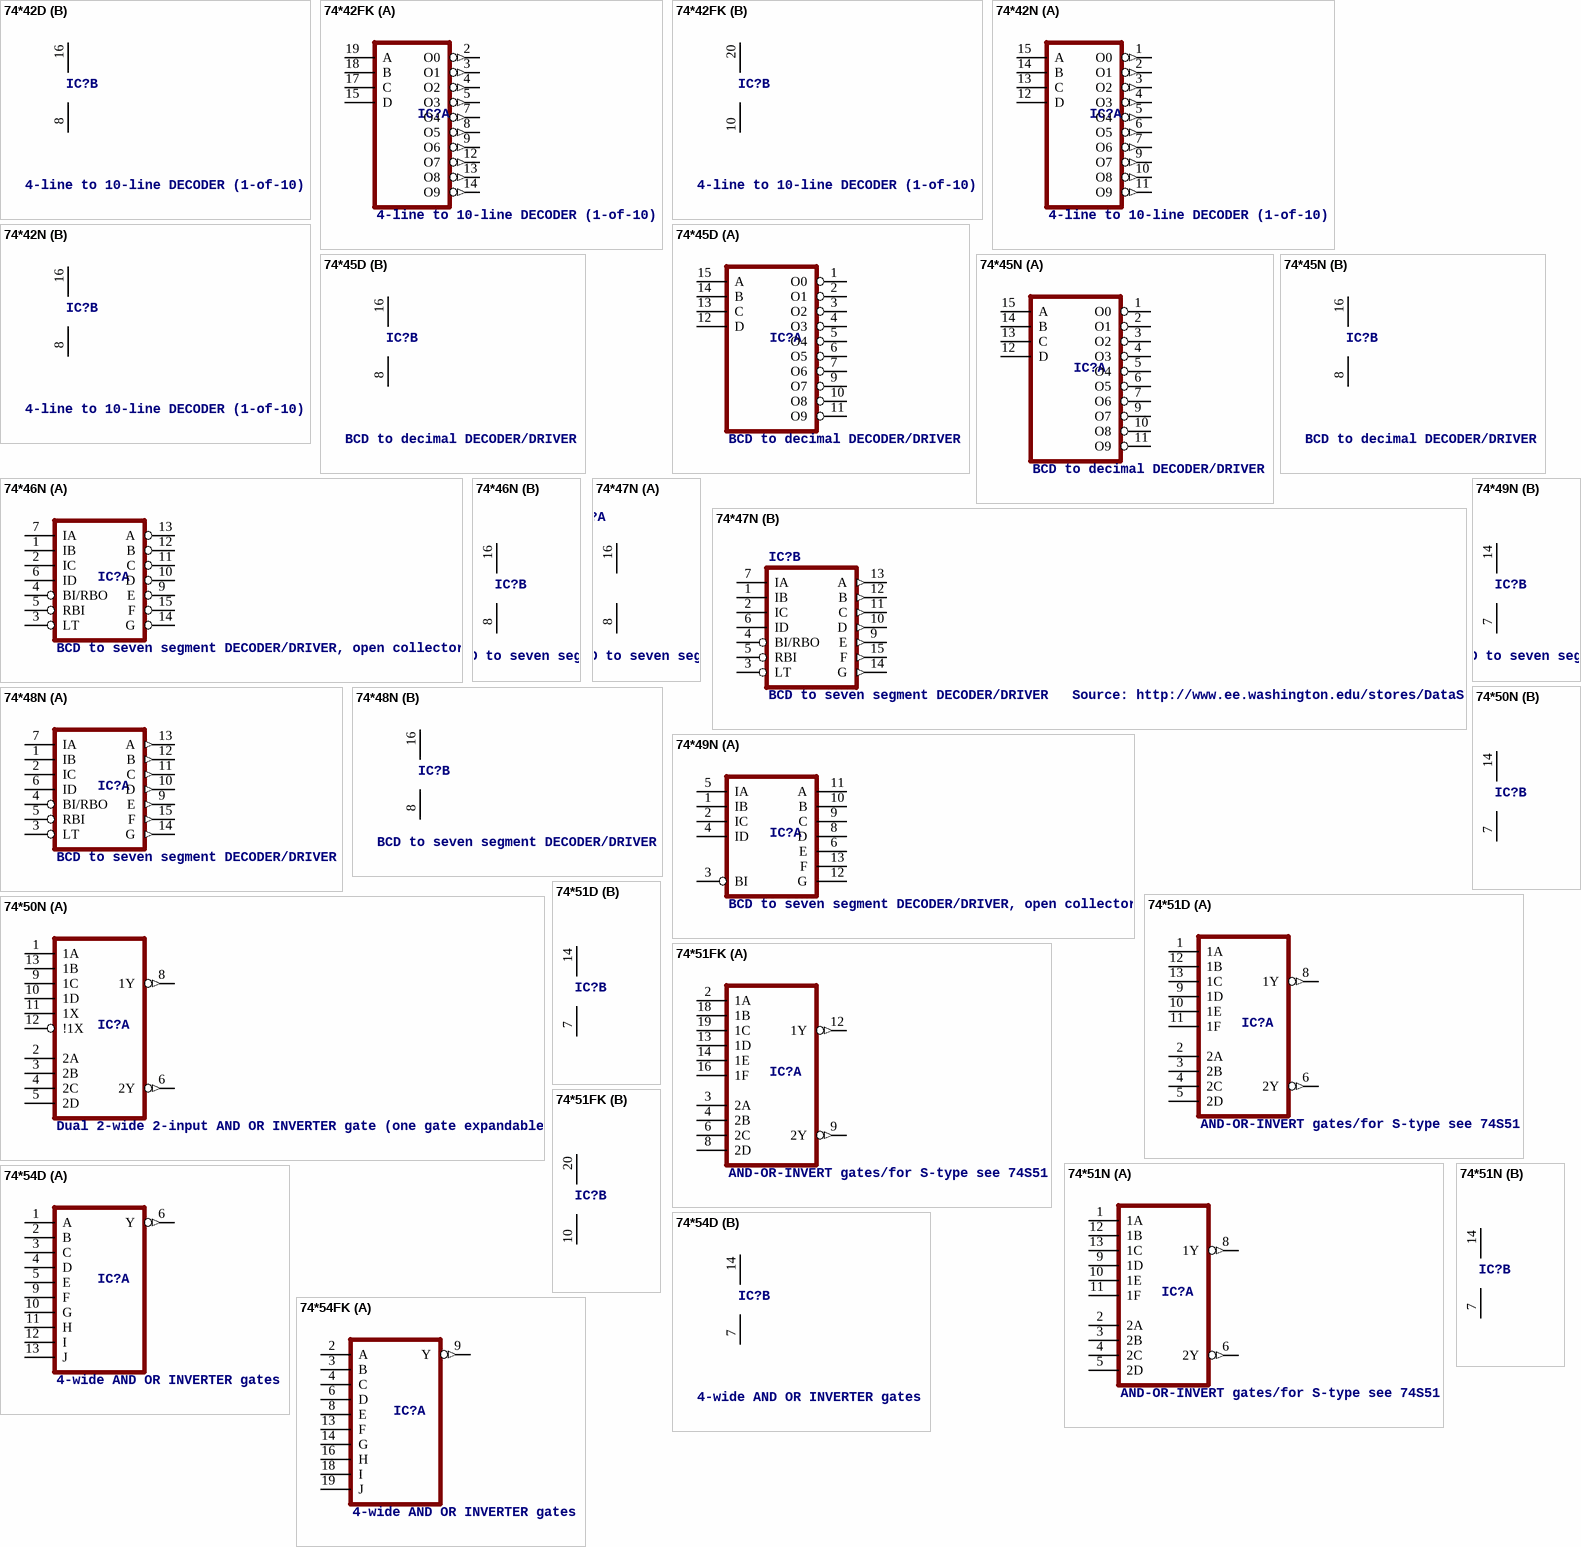
[diagram p10: symbols 74*42D to 74*54FK]

## 74*42D
designator IC?, comment 4-line to 10-line DECODER (1-of-10)
footprint SO16
part A pins: 1 O0 (out), 2 O1 (out), 3 O2 (out), 4 O3 (out), 5 O4 (out), 6 O5 (out), 7 O6 (out), 9 O7 (out), 10 O8 (out), 11 O9 (out), 12 D, 13 C, 14 B, 15 A
part B pins: 8 GND (power), 16 VCC (power)

## 74*42FK
designator IC?, comment 4-line to 10-line DECODER (1-of-10)
footprint LCC20
part A pins: 2 O0 (out), 3 O1 (out), 4 O2 (out), 5 O3 (out), 7 O4 (out), 8 O5 (out), 9 O6 (out), 12 O7 (out), 13 O8 (out), 14 O9 (out), 15 D, 17 C, 18 B, 19 A
part B pins: 10 GND (power), 20 VCC (power)

## 74*42N
designator IC?, comment 4-line to 10-line DECODER (1-of-10)
footprint DIL16
part A pins: 1 O0 (out), 2 O1 (out), 3 O2 (out), 4 O3 (out), 5 O4 (out), 6 O5 (out), 7 O6 (out), 9 O7 (out), 10 O8 (out), 11 O9 (out), 12 D, 13 C, 14 B, 15 A
part B pins: 8 GND (power), 16 VCC (power)

## 74*45D
designator IC?, comment BCD to decimal DECODER/DRIVER
footprint SO16
part A pins: 1 O0 (oc), 2 O1 (oc), 3 O2 (oc), 4 O3 (oc), 5 O4 (oc), 6 O5 (oc), 7 O6 (oc), 9 O7 (oc), 10 O8 (oc), 11 O9 (oc), 12 D, 13 C, 14 B, 15 A
part B pins: 8 GND (power), 16 VCC (power)

## 74*45N
designator IC?, comment BCD to decimal DECODER/DRIVER
footprint DIL16
part A pins: 1 O0 (oc), 2 O1 (oc), 3 O2 (oc), 4 O3 (oc), 5 O4 (oc), 6 O5 (oc), 7 O6 (oc), 9 O7 (oc), 10 O8 (oc), 11 O9 (oc), 12 D, 13 C, 14 B, 15 A
part B pins: 8 GND (power), 16 VCC (power)

## 74*46N
designator IC?, comment BCD to seven segment DECODER/DRIVER, open collector
footprint DIL16
part A pins: 1 IB, 2 IC, 3 LT, 4 BI/RBO, 5 RBI, 6 ID, 7 IA, 9 E (oc), 10 D (oc), 11 C (oc), 12 B (oc), 13 A (oc), 14 G (oc), 15 F (oc)
part B pins: 8 GND (power), 16 VCC (power)

## 74*47N
designator IC?, comment BCD to seven segment DECODER/DRIVER   Source: http://www.ee.washington.edu/stores/DataSheets/74ls/74ls47.pdf
footprint DIL16
part A pins: 8 GND (power), 16 VCC (power)
part B pins: 1 IB, 2 IC, 3 LT, 4 BI/RBO, 5 RBI, 6 ID, 7 IA, 9 E (out), 10 D (out), 11 C (out), 12 B (out), 13 A (out), 14 G (out), 15 F (out)

## 74*48N
designator IC?, comment BCD to seven segment DECODER/DRIVER
footprint DIL16
part A pins: 1 IB, 2 IC, 3 LT, 4 BI/RBO, 5 RBI, 6 ID, 7 IA, 9 E (out), 10 D (out), 11 C (out), 12 B (out), 13 A (out), 14 G (out), 15 F (out)
part B pins: 8 GND (power), 16 VCC (power)

## 74*49N
designator IC?, comment BCD to seven segment DECODER/DRIVER, open collector
footprint DIL14
part A pins: 1 IB, 2 IC, 3 BI, 4 ID, 5 IA, 6 E (oc), 8 D (oc), 9 C (oc), 10 B (oc), 11 A (oc), 12 G (oc), 13 F (oc)
part B pins: 7 GND (power), 14 VCC (power)

## 74*50N
designator IC?, comment Dual 2-wide 2-input AND OR INVERTER gate (one gate expandable)
footprint DIL14
part A pins: 1 1A, 2 2A, 3 2B, 4 2C, 5 2D, 6 2Y (out), 8 1Y (out), 9 1C, 10 1D, 11 1X, 12 !1X, 13 1B
part B pins: 7 GND (power), 14 VCC (power)

## 74*51D
designator IC?, comment AND-OR-INVERT gates/for S-type see 74S51
footprint SO14
part A pins: 1 1A, 2 2A, 3 2B, 4 2C, 5 2D, 6 2Y (out), 8 1Y (out), 9 1D, 10 1E, 11 1F, 12 1B, 13 1C
part B pins: 7 GND (power), 14 VCC (power)

## 74*51FK
designator IC?, comment AND-OR-INVERT gates/for S-type see 74S51
footprint PLCC20
part A pins: 2 1A, 3 2A, 4 2B, 6 2C, 8 2D, 9 2Y (out), 12 1Y (out), 13 1D, 14 1E, 16 1F, 18 1B, 19 1C
part B pins: 10 GND (power), 20 VCC (power)

## 74*51N
designator IC?, comment AND-OR-INVERT gates/for S-type see 74S51
footprint DIL14
part A pins: 1 1A, 2 2A, 3 2B, 4 2C, 5 2D, 6 2Y (out), 8 1Y (out), 9 1D, 10 1E, 11 1F, 12 1B, 13 1C
part B pins: 7 GND (power), 14 VCC (power)

## 74*54D
designator IC?, comment 4-wide AND OR INVERTER gates
footprint SO14
part A pins: 1 A, 2 B, 3 C, 4 D, 5 E, 6 Y (out), 9 F, 10 G, 11 H, 12 I, 13 J
part B pins: 7 GND (power), 14 VCC (power)

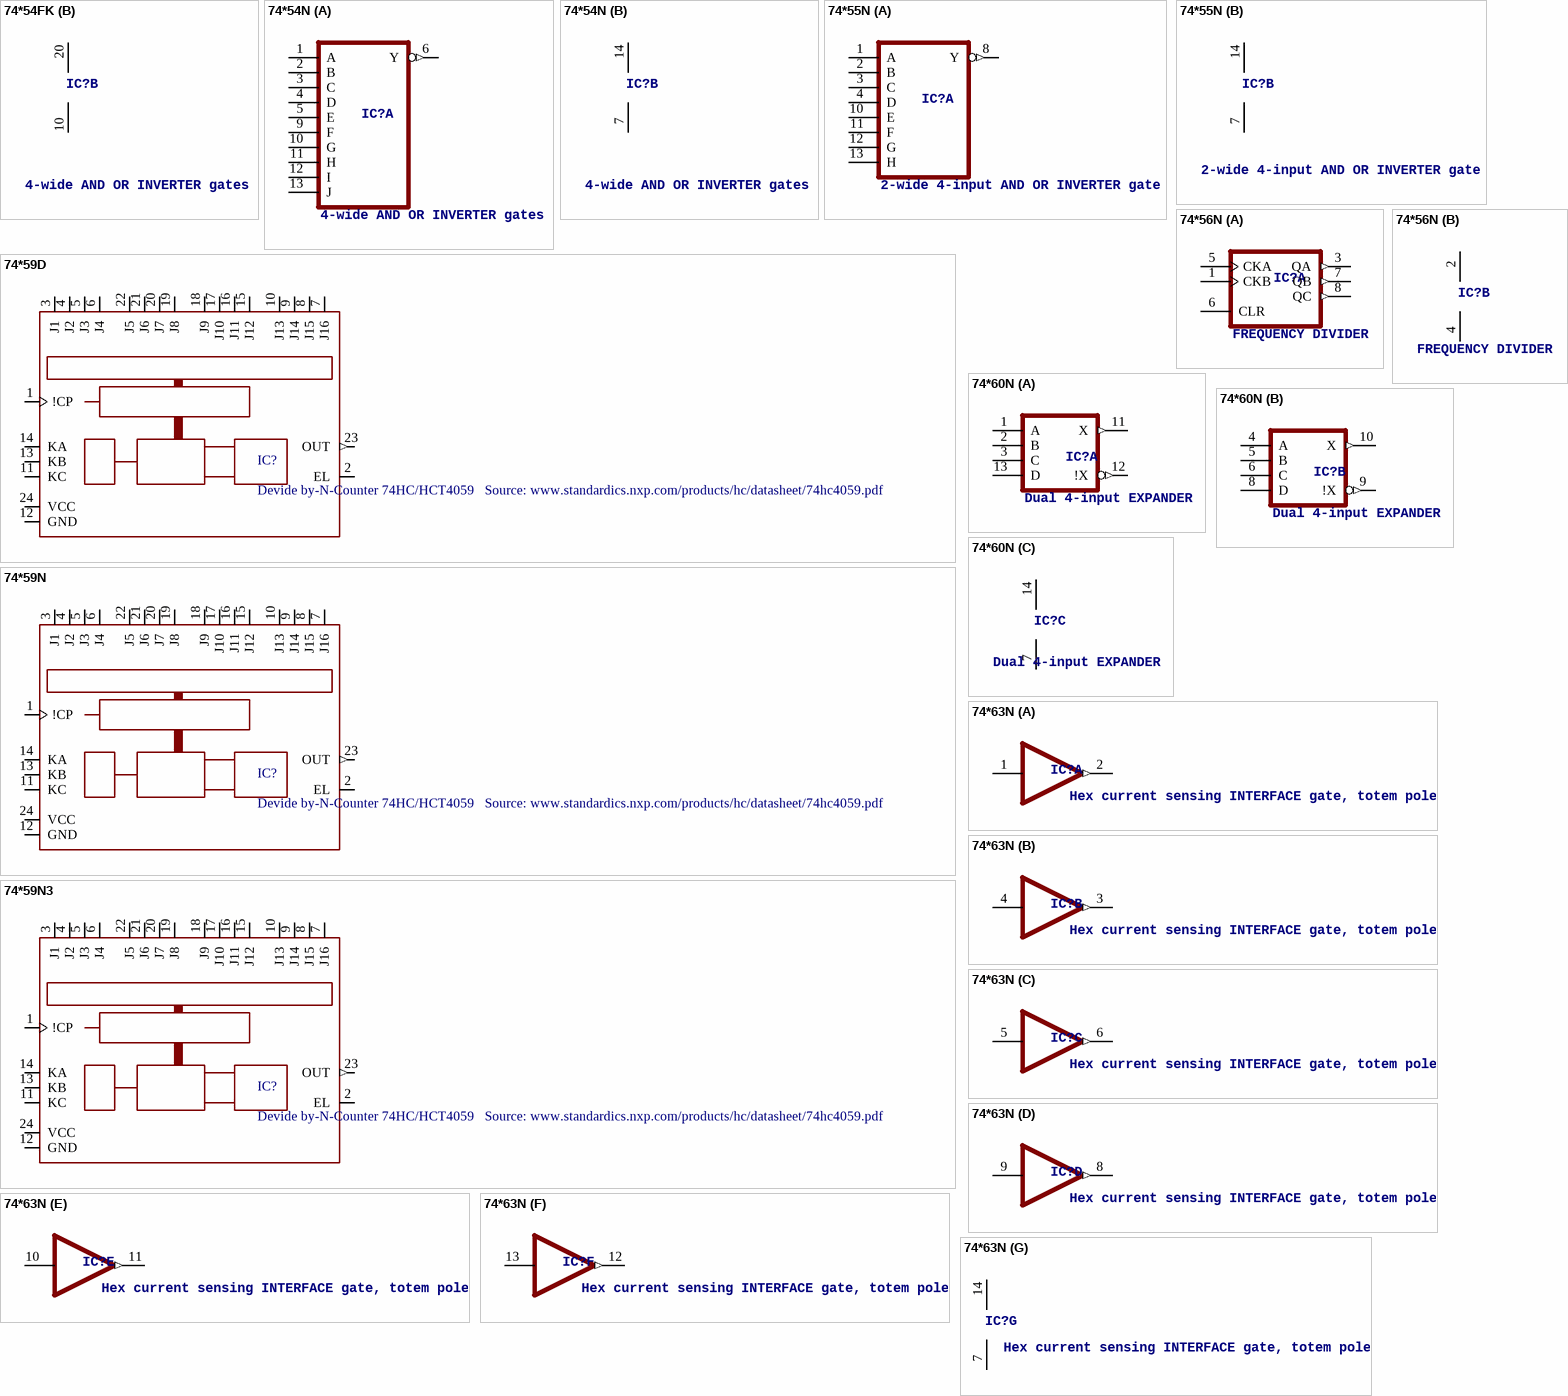
[diagram p11: symbols 74*54FK to 74*63N]

## 74*54FK
designator IC?, comment 4-wide AND OR INVERTER gates
footprint LCC20
part A pins: 2 A, 3 B, 4 C, 6 D, 8 E, 9 Y (out), 13 F, 14 G, 16 H, 18 I, 19 J
part B pins: 10 GND (power), 20 VCC (power)

## 74*54N
designator IC?, comment 4-wide AND OR INVERTER gates
footprint DIL14
part A pins: 1 A, 2 B, 3 C, 4 D, 5 E, 6 Y (out), 9 F, 10 G, 11 H, 12 I, 13 J
part B pins: 7 GND (power), 14 VCC (power)

## 74*55N
designator IC?, comment 2-wide 4-input AND OR INVERTER gate
footprint DIL14
part A pins: 1 A, 2 B, 3 C, 4 D, 8 Y (out), 10 E, 11 F, 12 G, 13 H
part B pins: 7 GND (power), 14 VCC (power)

## 74*56N
designator IC?, comment FREQUENCY DIVIDER
footprint DIL08
part A pins: 1 CKB, 3 QA (out), 5 CKA, 6 CLR, 7 QB (out), 8 QC (out)
part B pins: 2 VCC (power), 4 GND (power)

## 74*59D
designator IC?, comment Devide by-N-Counter 74HC/HCT4059   Source: www.standardics.nxp.com/products/hc/datasheet/74hc4059.pdf
footprint SO24W
pins: 1 !CP, 2 EL, 3 J1, 4 J2, 5 J3, 6 J4, 7 J16, 8 J15, 9 J14, 10 J13, 11 KC, 12 GND (power), 13 KB, 14 KA, 15 J12, 16 J11, 17 J10, 18 J9, 19 J8, 20 J7, 21 J6, 22 J5, 23 OUT (out), 24 VCC (power)

## 74*59N
designator IC?, comment Devide by-N-Counter 74HC/HCT4059   Source: www.standardics.nxp.com/products/hc/datasheet/74hc4059.pdf
footprint DIL28-6
pins: 1 !CP, 2 EL, 3 J1, 4 J2, 5 J3, 6 J4, 7 J16, 8 J15, 9 J14, 10 J13, 11 KC, 12 GND (power), 13 KB, 14 KA, 15 J12, 16 J11, 17 J10, 18 J9, 19 J8, 20 J7, 21 J6, 22 J5, 23 OUT (out), 24 VCC (power)

## 74*59N3
designator IC?, comment Devide by-N-Counter 74HC/HCT4059   Source: www.standardics.nxp.com/products/hc/datasheet/74hc4059.pdf
footprint DIL28-3
pins: 1 !CP, 2 EL, 3 J1, 4 J2, 5 J3, 6 J4, 7 J16, 8 J15, 9 J14, 10 J13, 11 KC, 12 GND (power), 13 KB, 14 KA, 15 J12, 16 J11, 17 J10, 18 J9, 19 J8, 20 J7, 21 J6, 22 J5, 23 OUT (out), 24 VCC (power)

## 74*60N
designator IC?, comment Dual 4-input EXPANDER
footprint DIL14
part A pins: 1 A, 2 B, 3 C, 11 X (out), 12 !X (out), 13 D
part B pins: 4 A, 5 B, 6 C, 8 D, 9 !X (out), 10 X (out)
part C pins: 7 GND (power), 14 VCC (power)

## 74*63N
designator IC?, comment Hex current sensing INTERFACE gate, totem pole
footprint DIL14
part A pins: 1 I, 2 O (out)
part B pins: 3 O (out), 4 I
part C pins: 5 I, 6 O (out)
part D pins: 8 O (out), 9 I
part E pins: 10 I, 11 O (out)
part F pins: 12 O (out), 13 I
part G pins: 7 GND (power), 14 VCC (power)

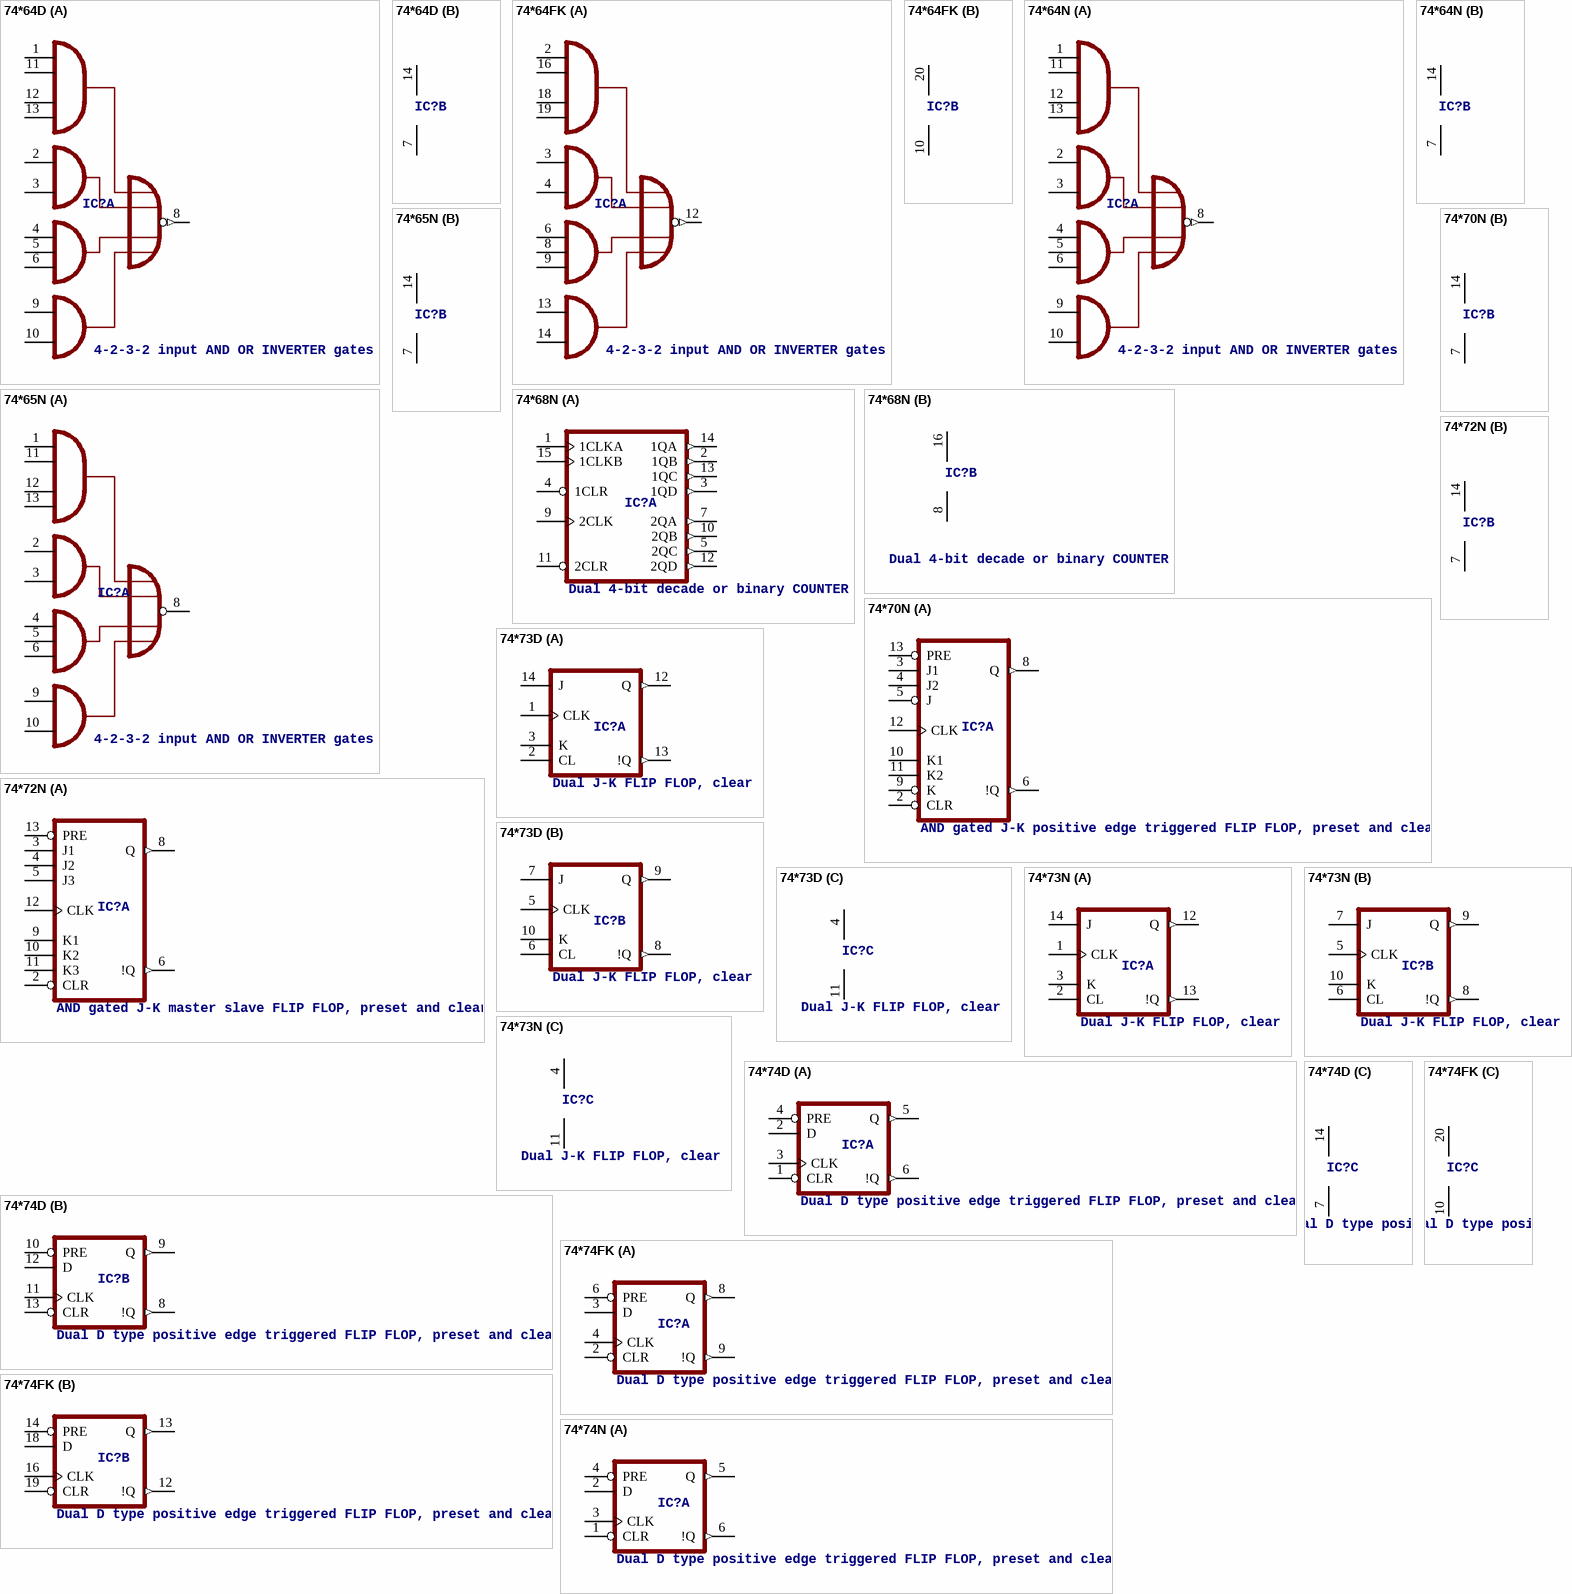
[diagram p12: symbols 74*64D to 74*74N]

## 74*64D
designator IC?, comment 4-2-3-2 input AND OR INVERTER gates
footprint SO14
part A pins: 1 I0, 2 I4, 3 I5, 4 I6, 5 I7, 6 I8, 8 O (out), 9 I9, 10 I10, 11 I1, 12 I2, 13 I3
part B pins: 7 GND (power), 14 VCC (power)

## 74*64FK
designator IC?, comment 4-2-3-2 input AND OR INVERTER gates
footprint LCC20
part A pins: 2 I0, 3 I4, 4 I5, 6 I6, 8 I7, 9 I8, 12 O (out), 13 I9, 14 I10, 16 I1, 18 I2, 19 I3
part B pins: 10 GND (power), 20 VCC (power)

## 74*64N
designator IC?, comment 4-2-3-2 input AND OR INVERTER gates
footprint DIL14
part A pins: 1 I0, 2 I4, 3 I5, 4 I6, 5 I7, 6 I8, 8 O (out), 9 I9, 10 I10, 11 I1, 12 I2, 13 I3
part B pins: 7 GND (power), 14 VCC (power)

## 74*65N
designator IC?, comment 4-2-3-2 input AND OR INVERTER gates
footprint DIL14
part A pins: 1 I0, 2 I4, 3 I5, 4 I6, 5 I7, 6 I8, 8 O (oc), 9 I9, 10 I10, 11 I1, 12 I2, 13 I3
part B pins: 7 GND (power), 14 VCC (power)

## 74*68N
designator IC?, comment Dual 4-bit decade or binary COUNTER
footprint DIL16
part A pins: 1 1CLKA, 2 1QB (out), 3 1QD (out), 4 1CLR, 5 2QC (out), 7 2QA (out), 9 2CLK, 10 2QB (out), 11 2CLR, 12 2QD (out), 13 1QC (out), 14 1QA (out), 15 1CLKB
part B pins: 8 GND (power), 16 VCC (power)

## 74*70N
designator IC?, comment AND gated J-K positive edge triggered FLIP FLOP, preset and clear
footprint DIL14
part A pins: 2 CLR, 3 J1, 4 J2, 5 J, 6 !Q (out), 8 Q (out), 9 K, 10 K1, 11 K2, 12 CLK, 13 PRE
part B pins: 7 GND (power), 14 VCC (power)

## 74*72N
designator IC?, comment AND gated J-K master slave FLIP FLOP, preset and clear
footprint DIL14
part A pins: 2 CLR, 3 J1, 4 J2, 5 J3, 6 !Q (out), 8 Q (out), 9 K1, 10 K2, 11 K3, 12 CLK, 13 PRE
part B pins: 7 GND (power), 14 VCC (power)

## 74*73D
designator IC?, comment Dual J-K FLIP FLOP, clear
footprint SO14
part A pins: 1 CLK, 2 CL, 3 K, 12 Q (out), 13 !Q (out), 14 J
part B pins: 5 CLK, 6 CL, 7 J, 8 !Q (out), 9 Q (out), 10 K
part C pins: 4 VCC (power), 11 GND (power)

## 74*73N
designator IC?, comment Dual J-K FLIP FLOP, clear
footprint DIL14
part A pins: 1 CLK, 2 CL, 3 K, 12 Q (out), 13 !Q (out), 14 J
part B pins: 5 CLK, 6 CL, 7 J, 8 !Q (out), 9 Q (out), 10 K
part C pins: 4 VCC (power), 11 GND (power)

## 74*74D
designator IC?, comment Dual D type positive edge triggered FLIP FLOP, preset and clear
footprint SO14
part A pins: 1 CLR, 2 D, 3 CLK, 4 PRE, 5 Q (out), 6 !Q (out)
part B pins: 8 !Q (out), 9 Q (out), 10 PRE, 11 CLK, 12 D, 13 CLR
part C pins: 7 GND (power), 14 VCC (power)

## 74*74FK
designator IC?, comment Dual D type positive edge triggered FLIP FLOP, preset and clear
footprint LCC20
part A pins: 2 CLR, 3 D, 4 CLK, 6 PRE, 8 Q (out), 9 !Q (out)
part B pins: 12 !Q (out), 13 Q (out), 14 PRE, 16 CLK, 18 D, 19 CLR
part C pins: 10 GND (power), 20 VCC (power)

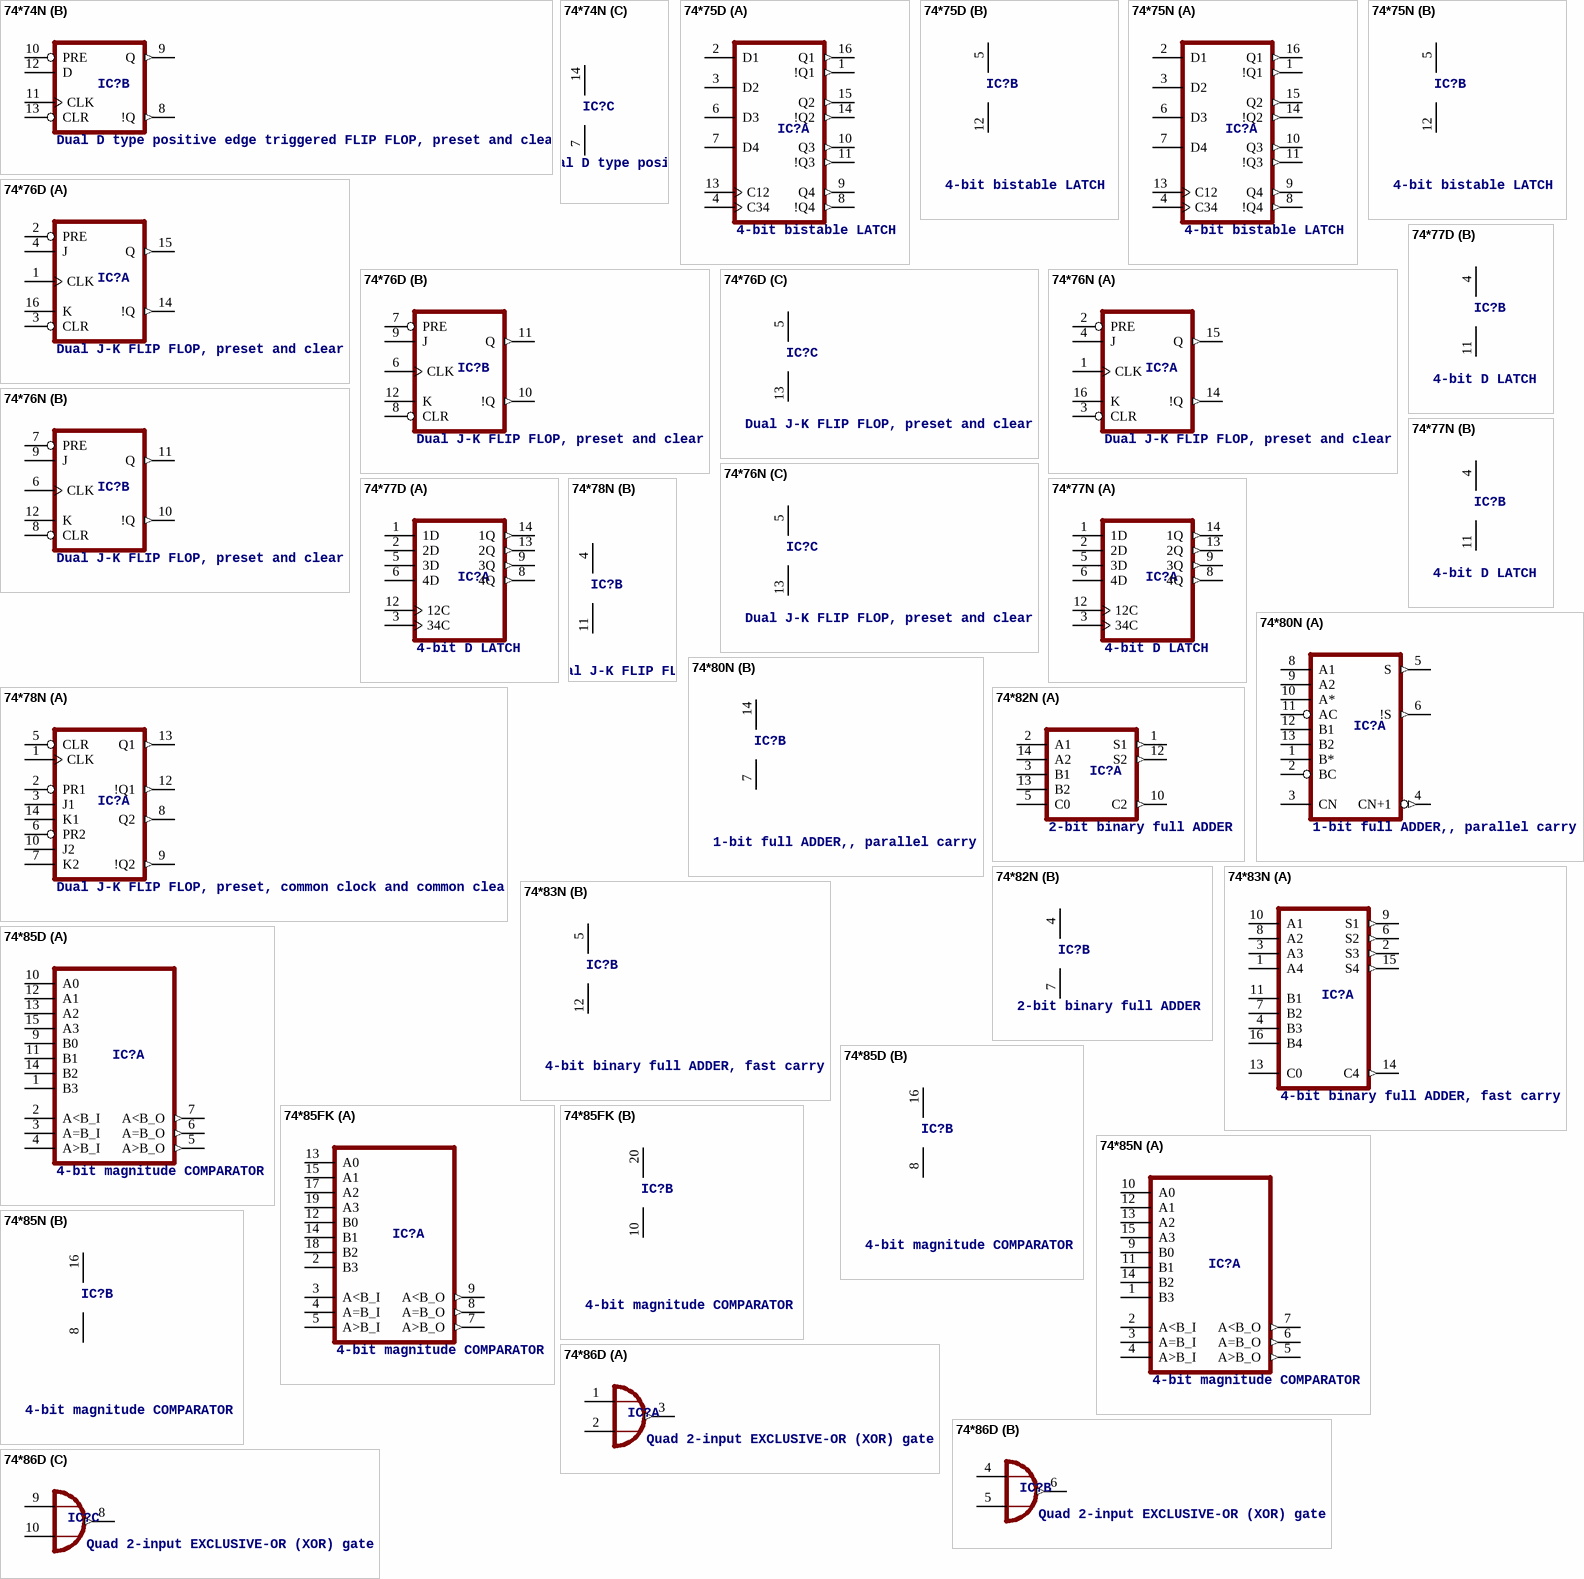
[diagram p13: symbols 74*74N to 74*86D]

## 74*74N
designator IC?, comment Dual D type positive edge triggered FLIP FLOP, preset and clear
footprint DIL14
part A pins: 1 CLR, 2 D, 3 CLK, 4 PRE, 5 Q (out), 6 !Q (out)
part B pins: 8 !Q (out), 9 Q (out), 10 PRE, 11 CLK, 12 D, 13 CLR
part C pins: 7 GND (power), 14 VCC (power)

## 74*75D
designator IC?, comment 4-bit bistable LATCH
footprint SO16
part A pins: 1 !Q1 (out), 2 D1, 3 D2, 4 C34, 6 D3, 7 D4, 8 !Q4 (out), 9 Q4 (out), 10 Q3 (out), 11 !Q3 (out), 13 C12, 14 !Q2 (out), 15 Q2 (out), 16 Q1 (out)
part B pins: 5 VCC (power), 12 GND (power)

## 74*75N
designator IC?, comment 4-bit bistable LATCH
footprint DIL16
part A pins: 1 !Q1 (out), 2 D1, 3 D2, 4 C34, 6 D3, 7 D4, 8 !Q4 (out), 9 Q4 (out), 10 Q3 (out), 11 !Q3 (out), 13 C12, 14 !Q2 (out), 15 Q2 (out), 16 Q1 (out)
part B pins: 5 VCC (power), 12 GND (power)

## 74*76D
designator IC?, comment Dual J-K FLIP FLOP, preset and clear
footprint SO16
part A pins: 1 CLK, 2 PRE, 3 CLR, 4 J, 14 !Q (out), 15 Q (out), 16 K
part B pins: 6 CLK, 7 PRE, 8 CLR, 9 J, 10 !Q (out), 11 Q (out), 12 K
part C pins: 5 VCC (power), 13 GND (power)

## 74*76N
designator IC?, comment Dual J-K FLIP FLOP, preset and clear
footprint DIL16
part A pins: 1 CLK, 2 PRE, 3 CLR, 4 J, 14 !Q (out), 15 Q (out), 16 K
part B pins: 6 CLK, 7 PRE, 8 CLR, 9 J, 10 !Q (out), 11 Q (out), 12 K
part C pins: 5 VCC (power), 13 GND (power)

## 74*77D
designator IC?, comment 4-bit D LATCH
footprint SO14
part A pins: 1 1D, 2 2D, 3 34C, 5 3D, 6 4D, 8 4Q (out), 9 3Q (out), 12 12C, 13 2Q (out), 14 1Q (out)
part B pins: 4 VCC (power), 11 GND (power)

## 74*77N
designator IC?, comment 4-bit D LATCH
footprint DIL14
part A pins: 1 1D, 2 2D, 3 34C, 5 3D, 6 4D, 8 4Q (out), 9 3Q (out), 12 12C, 13 2Q (out), 14 1Q (out)
part B pins: 4 VCC (power), 11 GND (power)

## 74*78N
designator IC?, comment Dual J-K FLIP FLOP, preset, common clock and common clear
footprint DIL14
part A pins: 1 CLK, 2 PR1, 3 J1, 5 CLR, 6 PR2, 7 K2, 8 Q2 (out), 9 !Q2 (out), 10 J2, 12 !Q1 (out), 13 Q1 (out), 14 K1
part B pins: 4 VCC (power), 11 GND (power)

## 74*80N
designator IC?, comment 1-bit full ADDER,, parallel carry
footprint DIL14
part A pins: 1 B*, 2 BC, 3 CN, 4 CN+1 (out), 5 S (out), 6 !S (out), 8 A1, 9 A2, 10 A*, 11 AC, 12 B1, 13 B2
part B pins: 7 GND (power), 14 VCC (power)

## 74*82N
designator IC?, comment 2-bit binary full ADDER
footprint DIL14
part A pins: 1 S1 (out), 2 A1, 3 B1, 5 C0, 10 C2 (out), 12 S2 (out), 13 B2, 14 A2
part B pins: 4 VCC (power), 7 GND (power)

## 74*83N
designator IC?, comment 4-bit binary full ADDER, fast carry
footprint DIL16
part A pins: 1 A4, 2 S3 (out), 3 A3, 4 B3, 6 S2 (out), 7 B2, 8 A2, 9 S1 (out), 10 A1, 11 B1, 13 C0, 14 C4 (out), 15 S4 (out), 16 B4
part B pins: 5 VCC (power), 12 GND (power)

## 74*85D
designator IC?, comment 4-bit magnitude COMPARATOR
footprint SO16
part A pins: 1 B3, 2 A<B_I, 3 A=B_I, 4 A>B_I, 5 A>B_O (out), 6 A=B_O (out), 7 A<B_O (out), 9 B0, 10 A0, 11 B1, 12 A1, 13 A2, 14 B2, 15 A3
part B pins: 8 GND (power), 16 VCC (power)

## 74*85FK
designator IC?, comment 4-bit magnitude COMPARATOR
footprint LCC20
part A pins: 2 B3, 3 A<B_I, 4 A=B_I, 5 A>B_I, 7 A>B_O (out), 8 A=B_O (out), 9 A<B_O (out), 12 B0, 13 A0, 14 B1, 15 A1, 17 A2, 18 B2, 19 A3
part B pins: 10 GND (power), 20 VCC (power)

## 74*85N
designator IC?, comment 4-bit magnitude COMPARATOR
footprint DIL16
part A pins: 1 B3, 2 A<B_I, 3 A=B_I, 4 A>B_I, 5 A>B_O (out), 6 A=B_O (out), 7 A<B_O (out), 9 B0, 10 A0, 11 B1, 12 A1, 13 A2, 14 B2, 15 A3
part B pins: 8 GND (power), 16 VCC (power)

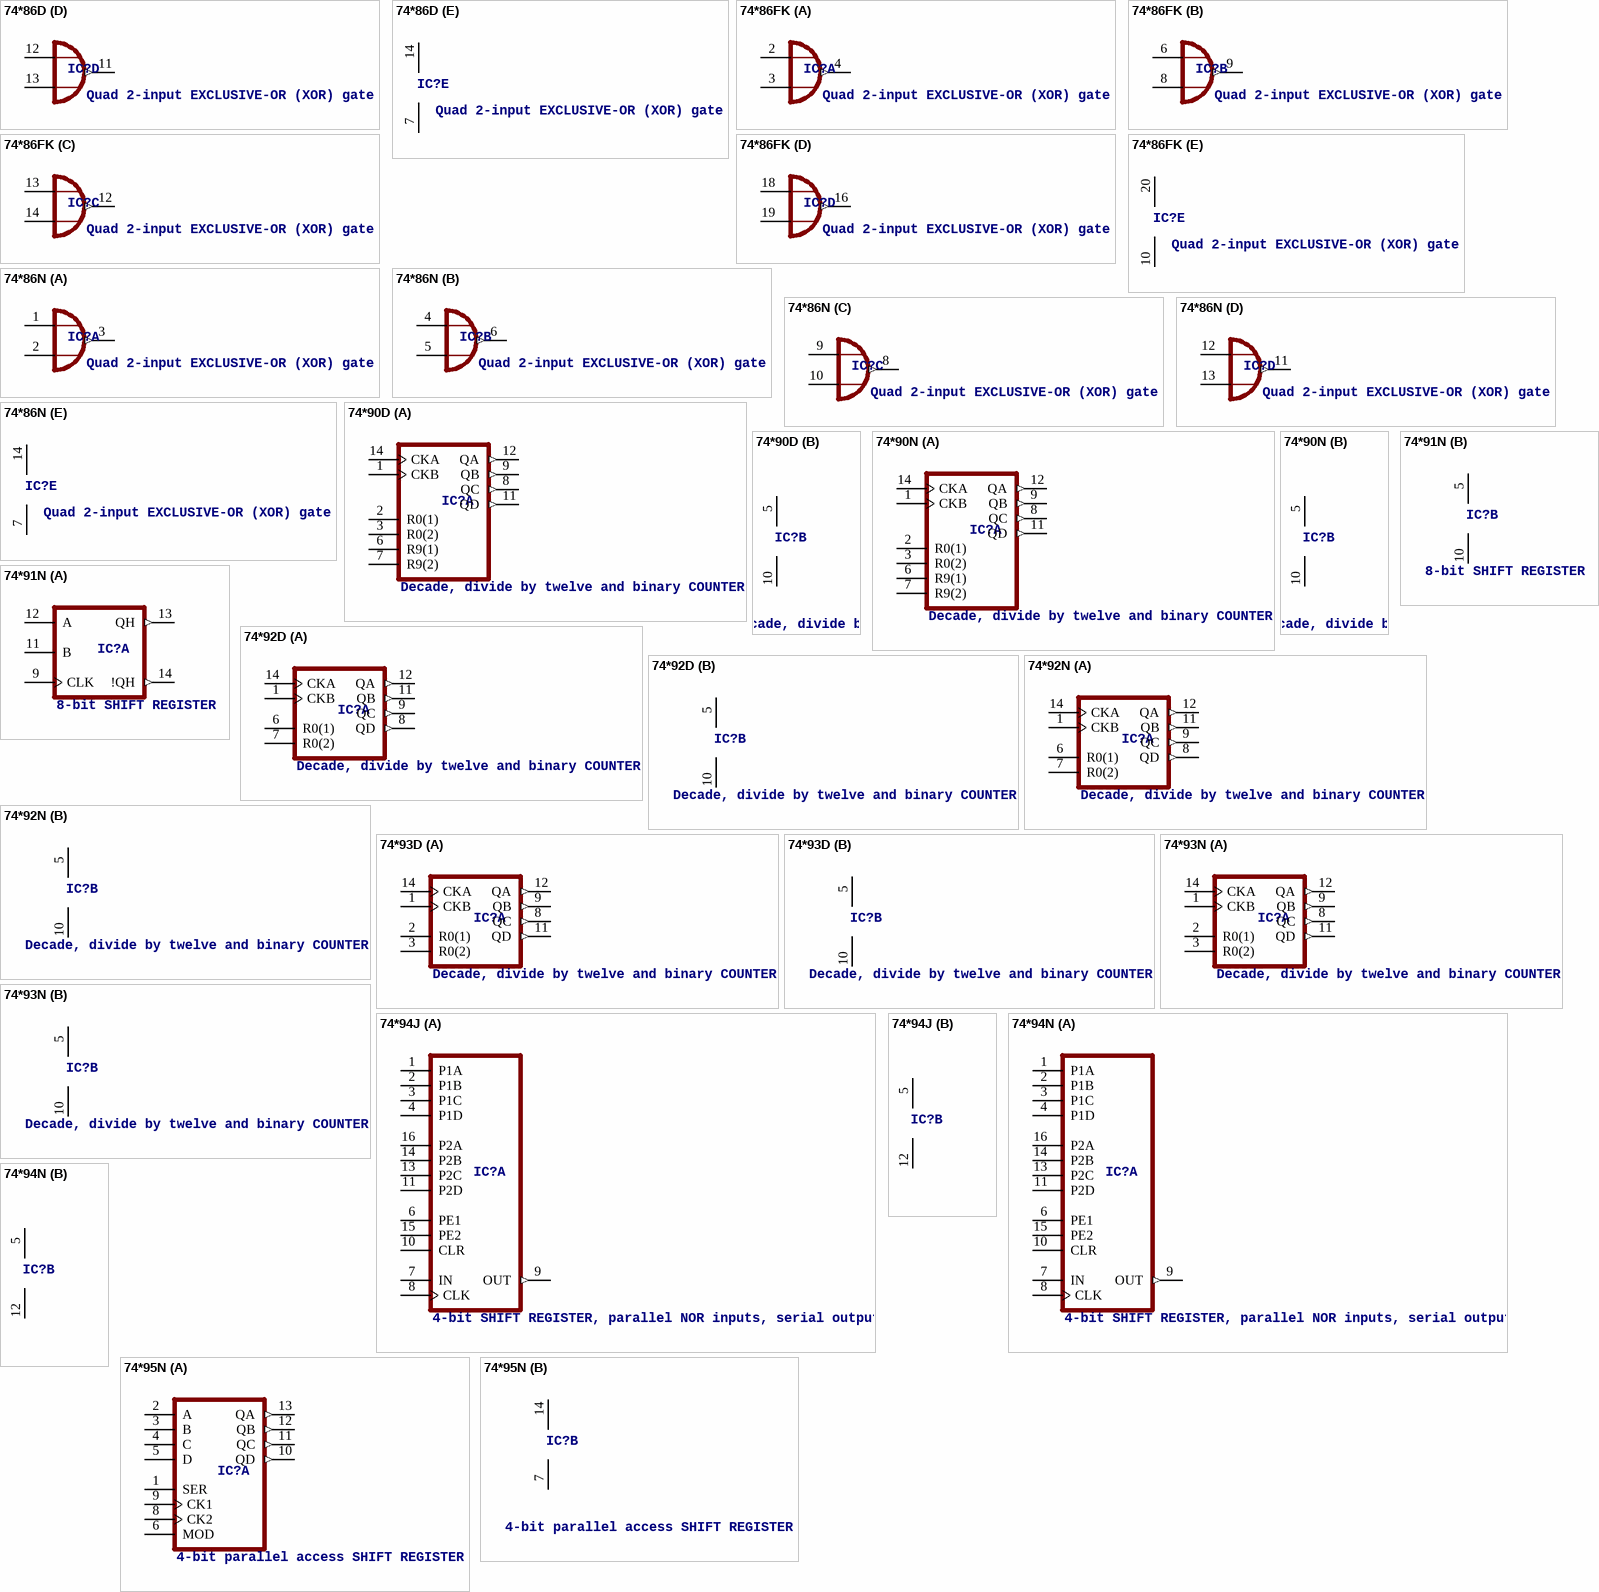
[diagram p14: symbols 74*86D to 74*95N]

## 74*86D
designator IC?, comment Quad 2-input EXCLUSIVE-OR (XOR) gate
footprint SO14
part A pins: 1 I0, 2 I1, 3 O (out)
part B pins: 4 I0, 5 I1, 6 O (out)
part C pins: 8 O (out), 9 I0, 10 I1
part D pins: 11 O (out), 12 I0, 13 I1
part E pins: 7 GND (power), 14 VCC (power)

## 74*86FK
designator IC?, comment Quad 2-input EXCLUSIVE-OR (XOR) gate
footprint LCC20
part A pins: 2 I0, 3 I1, 4 O (out)
part B pins: 6 I0, 8 I1, 9 O (out)
part C pins: 12 O (out), 13 I0, 14 I1
part D pins: 16 O (out), 18 I0, 19 I1
part E pins: 10 GND (power), 20 VCC (power)

## 74*86N
designator IC?, comment Quad 2-input EXCLUSIVE-OR (XOR) gate
footprint DIL14
part A pins: 1 I0, 2 I1, 3 O (out)
part B pins: 4 I0, 5 I1, 6 O (out)
part C pins: 8 O (out), 9 I0, 10 I1
part D pins: 11 O (out), 12 I0, 13 I1
part E pins: 7 GND (power), 14 VCC (power)

## 74*90D
designator IC?, comment Decade, divide by twelve and binary COUNTER
footprint SO14
part A pins: 1 CKB, 2 R0(1), 3 R0(2), 6 R9(1), 7 R9(2), 8 QC (out), 9 QB (out), 11 QD (out), 12 QA (out), 14 CKA
part B pins: 5 VCC (power), 10 GND (power)

## 74*90N
designator IC?, comment Decade, divide by twelve and binary COUNTER
footprint DIL14
part A pins: 1 CKB, 2 R0(1), 3 R0(2), 6 R9(1), 7 R9(2), 8 QC (out), 9 QB (out), 11 QD (out), 12 QA (out), 14 CKA
part B pins: 5 VCC (power), 10 GND (power)

## 74*91N
designator IC?, comment 8-bit SHIFT REGISTER
footprint DIL14
part A pins: 9 CLK, 11 B, 12 A, 13 QH (out), 14 !QH (out)
part B pins: 5 VCC (power), 10 GND (power)

## 74*92D
designator IC?, comment Decade, divide by twelve and binary COUNTER
footprint SO14
part A pins: 1 CKB, 6 R0(1), 7 R0(2), 8 QD (out), 9 QC (out), 11 QB (out), 12 QA (out), 14 CKA
part B pins: 5 VCC (power), 10 GND (power)

## 74*92N
designator IC?, comment Decade, divide by twelve and binary COUNTER
footprint DIL14
part A pins: 1 CKB, 6 R0(1), 7 R0(2), 8 QD (out), 9 QC (out), 11 QB (out), 12 QA (out), 14 CKA
part B pins: 5 VCC (power), 10 GND (power)

## 74*93D
designator IC?, comment Decade, divide by twelve and binary COUNTER
footprint SO14
part A pins: 1 CKB, 2 R0(1), 3 R0(2), 8 QC (out), 9 QB (out), 11 QD (out), 12 QA (out), 14 CKA
part B pins: 5 VCC (power), 10 GND (power)

## 74*93N
designator IC?, comment Decade, divide by twelve and binary COUNTER
footprint DIL14
part A pins: 1 CKB, 2 R0(1), 3 R0(2), 8 QC (out), 9 QB (out), 11 QD (out), 12 QA (out), 14 CKA
part B pins: 5 VCC (power), 10 GND (power)

## 74*94J
designator IC?, comment 4-bit SHIFT REGISTER, parallel NOR inputs, serial output
footprint SO16
part A pins: 1 P1A, 2 P1B, 3 P1C, 4 P1D, 6 PE1, 7 IN, 8 CLK, 9 OUT (out), 10 CLR, 11 P2D, 13 P2C, 14 P2B, 15 PE2, 16 P2A
part B pins: 5 VCC (power), 12 GND (power)

## 74*94N
designator IC?, comment 4-bit SHIFT REGISTER, parallel NOR inputs, serial output
footprint DIL16
part A pins: 1 P1A, 2 P1B, 3 P1C, 4 P1D, 6 PE1, 7 IN, 8 CLK, 9 OUT (out), 10 CLR, 11 P2D, 13 P2C, 14 P2B, 15 PE2, 16 P2A
part B pins: 5 VCC (power), 12 GND (power)

## 74*95N
designator IC?, comment 4-bit parallel access SHIFT REGISTER
footprint DIL14
part A pins: 1 SER, 2 A, 3 B, 4 C, 5 D, 6 MOD, 8 CK2, 9 CK1, 10 QD (out), 11 QC (out), 12 QB (out), 13 QA (out)
part B pins: 7 GND (power), 14 VCC (power)

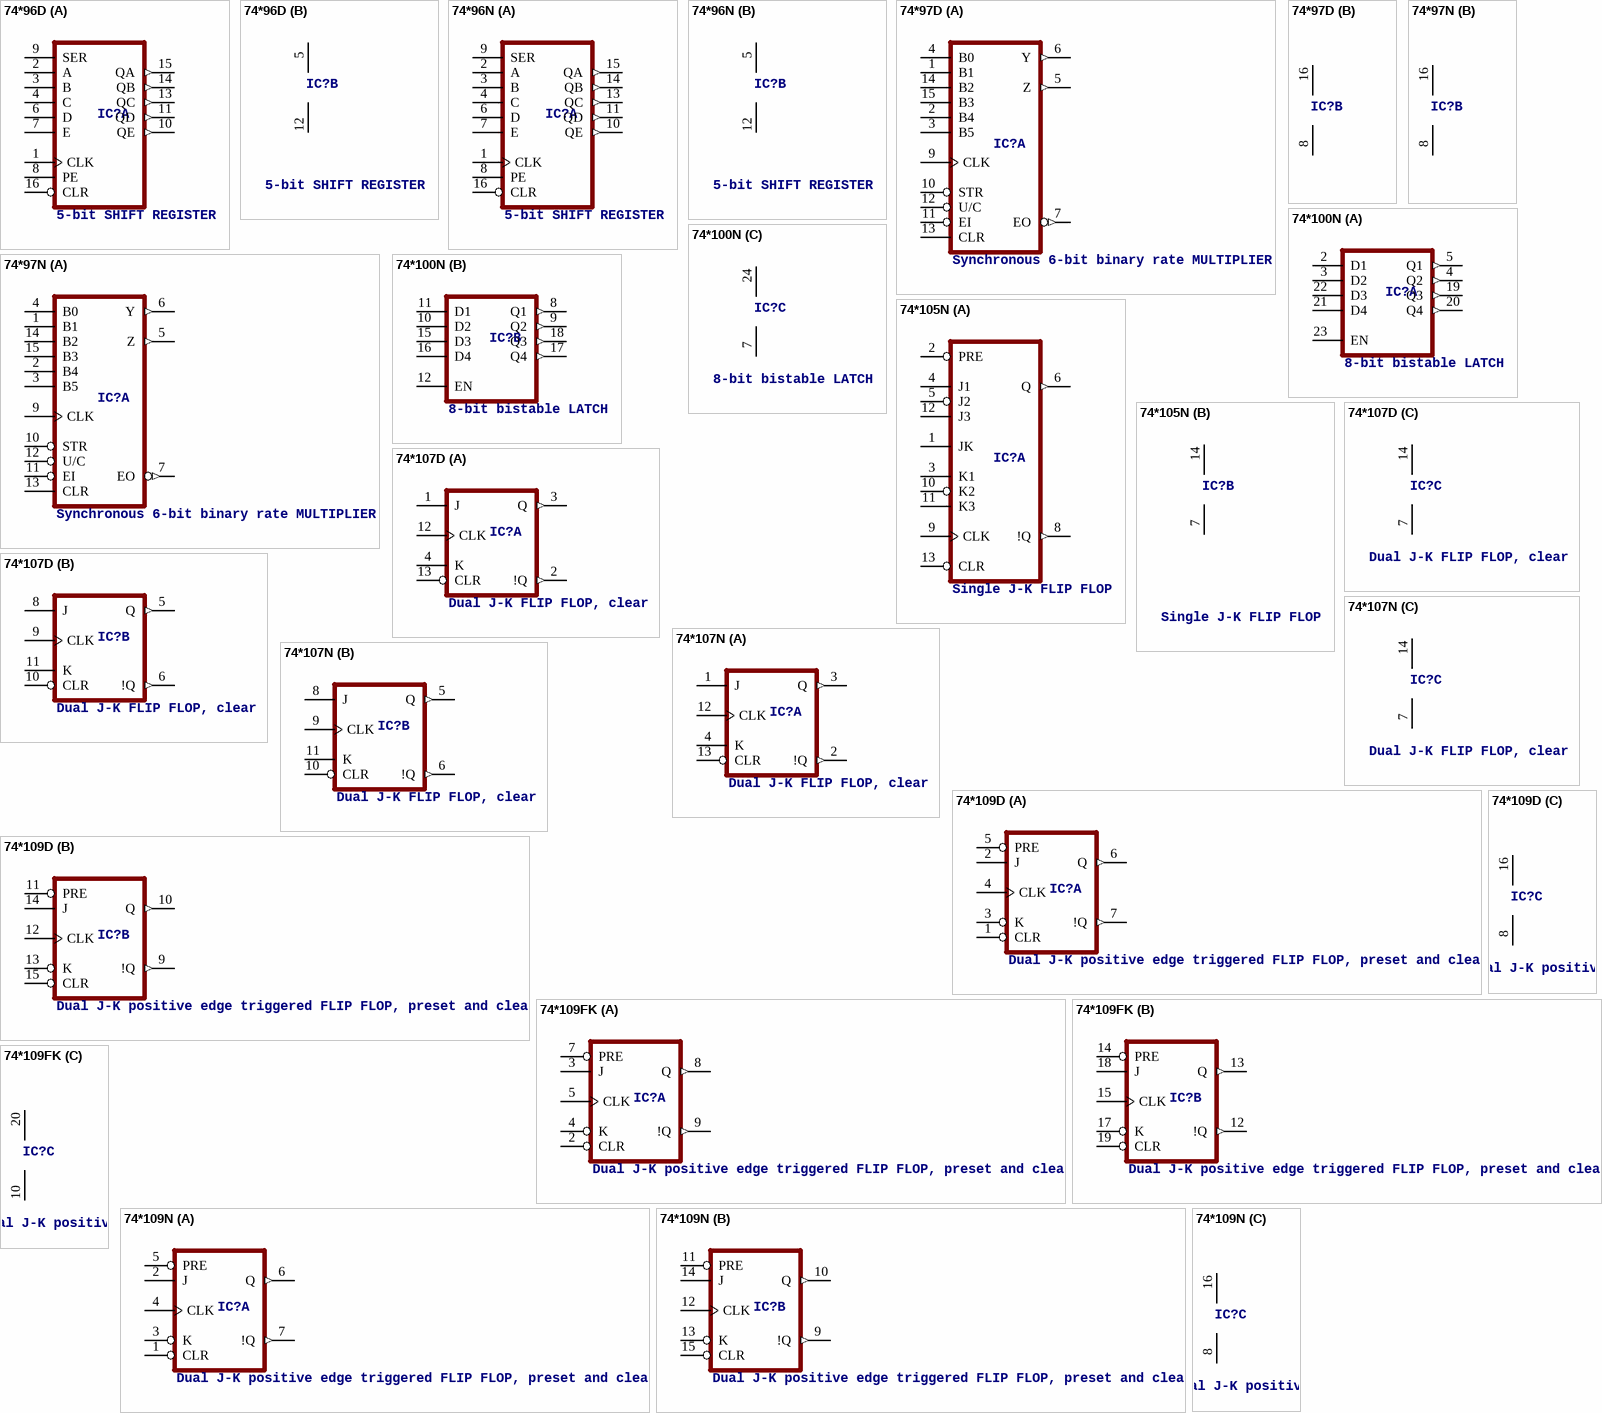
[diagram p15: symbols 74*96D to 74*109N]

## 74*96D
designator IC?, comment 5-bit SHIFT REGISTER
footprint SO16
part A pins: 1 CLK, 2 A, 3 B, 4 C, 6 D, 7 E, 8 PE, 9 SER, 10 QE (out), 11 QD (out), 13 QC (out), 14 QB (out), 15 QA (out), 16 CLR
part B pins: 5 VCC (power), 12 GND (power)

## 74*96N
designator IC?, comment 5-bit SHIFT REGISTER
footprint DIL16
part A pins: 1 CLK, 2 A, 3 B, 4 C, 6 D, 7 E, 8 PE, 9 SER, 10 QE (out), 11 QD (out), 13 QC (out), 14 QB (out), 15 QA (out), 16 CLR
part B pins: 5 VCC (power), 12 GND (power)

## 74*97D
designator IC?, comment Synchronous 6-bit binary rate MULTIPLIER
footprint SO16
part A pins: 1 B1, 2 B4, 3 B5, 4 B0, 5 Z (out), 6 Y (out), 7 EO (out), 9 CLK, 10 STR, 11 EI, 12 U/C, 13 CLR, 14 B2, 15 B3
part B pins: 8 GND (power), 16 VCC (power)

## 74*97N
designator IC?, comment Synchronous 6-bit binary rate MULTIPLIER
footprint DIL16
part A pins: 1 B1, 2 B4, 3 B5, 4 B0, 5 Z (out), 6 Y (out), 7 EO (out), 9 CLK, 10 STR, 11 EI, 12 U/C, 13 CLR, 14 B2, 15 B3
part B pins: 8 GND (power), 16 VCC (power)

## 74*100N
designator IC?, comment 8-bit bistable LATCH
footprint DIL24-6
part A pins: 2 D1, 3 D2, 4 Q2 (out), 5 Q1 (out), 19 Q3 (out), 20 Q4 (out), 21 D4, 22 D3, 23 EN
part B pins: 8 Q1 (out), 9 Q2 (out), 10 D2, 11 D1, 12 EN, 15 D3, 16 D4, 17 Q4 (out), 18 Q3 (out)
part C pins: 7 GND (power), 24 VCC (power)

## 74*105N
designator IC?, comment Single J-K FLIP FLOP
footprint DIL14
part A pins: 1 JK, 2 PRE, 3 K1, 4 J1, 5 J2, 6 Q (out), 8 !Q (out), 9 CLK, 10 K2, 11 K3, 12 J3, 13 CLR
part B pins: 7 GND (power), 14 VCC (power)

## 74*107D
designator IC?, comment Dual J-K FLIP FLOP, clear
footprint SO14
part A pins: 1 J, 2 !Q (out), 3 Q (out), 4 K, 12 CLK, 13 CLR
part B pins: 5 Q (out), 6 !Q (out), 8 J, 9 CLK, 10 CLR, 11 K
part C pins: 7 GND (power), 14 VCC (power)

## 74*107N
designator IC?, comment Dual J-K FLIP FLOP, clear
footprint DIL14
part A pins: 1 J, 2 !Q (out), 3 Q (out), 4 K, 12 CLK, 13 CLR
part B pins: 5 Q (out), 6 !Q (out), 8 J, 9 CLK, 10 CLR, 11 K
part C pins: 7 GND (power), 14 VCC (power)

## 74*109D
designator IC?, comment Dual J-K positive edge triggered FLIP FLOP, preset and clear
footprint SO16
part A pins: 1 CLR, 2 J, 3 K, 4 CLK, 5 PRE, 6 Q (out), 7 !Q (out)
part B pins: 9 !Q (out), 10 Q (out), 11 PRE, 12 CLK, 13 K, 14 J, 15 CLR
part C pins: 8 GND (power), 16 VCC (power)

## 74*109FK
designator IC?, comment Dual J-K positive edge triggered FLIP FLOP, preset and clear
footprint LCC20
part A pins: 2 CLR, 3 J, 4 K, 5 CLK, 7 PRE, 8 Q (out), 9 !Q (out)
part B pins: 12 !Q (out), 13 Q (out), 14 PRE, 15 CLK, 17 K, 18 J, 19 CLR
part C pins: 10 GND (power), 20 VCC (power)

## 74*109N
designator IC?, comment Dual J-K positive edge triggered FLIP FLOP, preset and clear
footprint DIL16
part A pins: 1 CLR, 2 J, 3 K, 4 CLK, 5 PRE, 6 Q (out), 7 !Q (out)
part B pins: 9 !Q (out), 10 Q (out), 11 PRE, 12 CLK, 13 K, 14 J, 15 CLR
part C pins: 8 GND (power), 16 VCC (power)

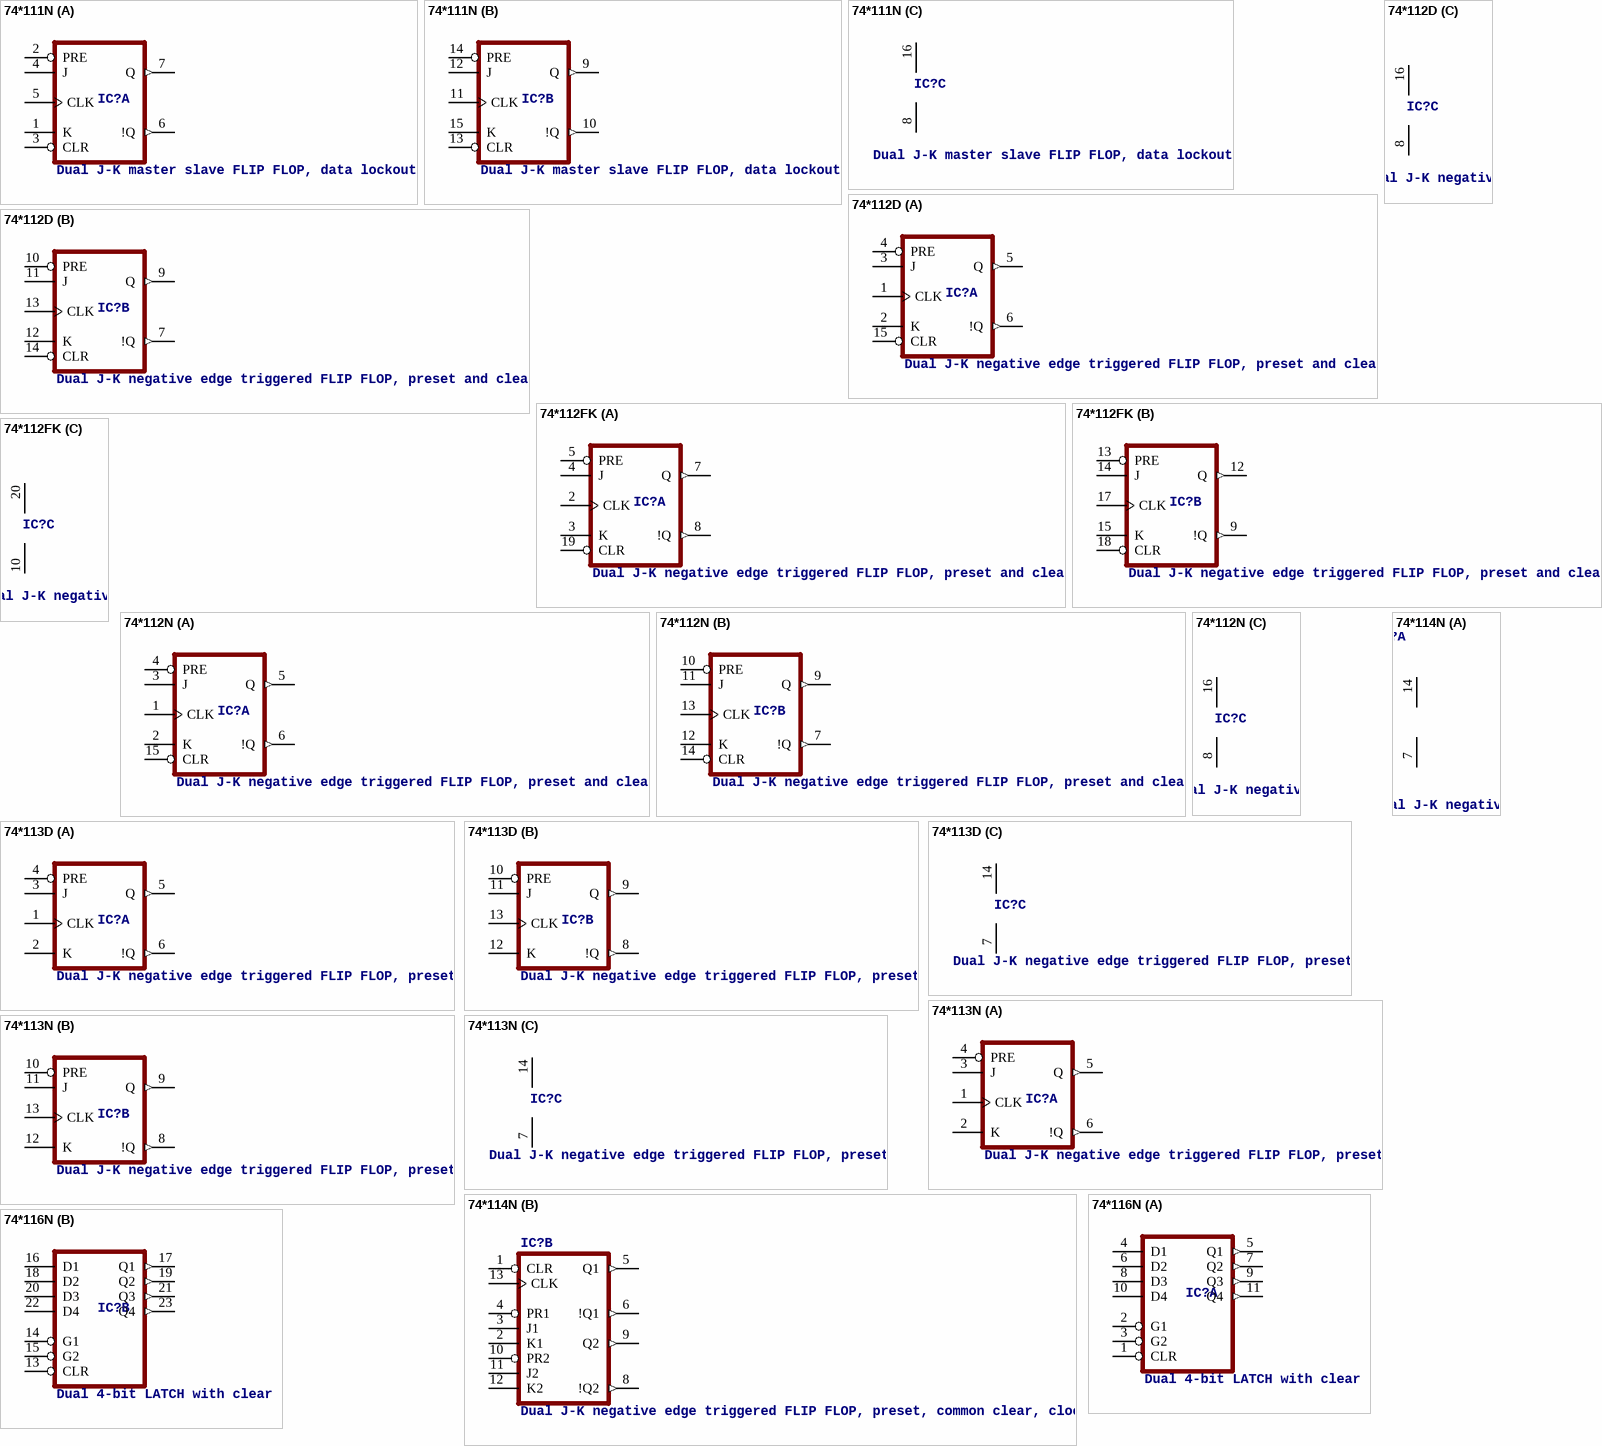
[diagram p16: symbols 74*111N to 74*116N]

## 74*111N
designator IC?, comment Dual J-K master slave FLIP FLOP, data lockout
footprint DIL16
part A pins: 1 K, 2 PRE, 3 CLR, 4 J, 5 CLK, 6 !Q (out), 7 Q (out)
part B pins: 9 Q (out), 10 !Q (out), 11 CLK, 12 J, 13 CLR, 14 PRE, 15 K
part C pins: 8 GND (power), 16 VCC (power)

## 74*112D
designator IC?, comment Dual J-K negative edge triggered FLIP FLOP, preset and clear
footprint SO16
part A pins: 1 CLK, 2 K, 3 J, 4 PRE, 5 Q (out), 6 !Q (out), 15 CLR
part B pins: 7 !Q (out), 9 Q (out), 10 PRE, 11 J, 12 K, 13 CLK, 14 CLR
part C pins: 8 GND (power), 16 VCC (power)

## 74*112FK
designator IC?, comment Dual J-K negative edge triggered FLIP FLOP, preset and clear
footprint LCC20
part A pins: 2 CLK, 3 K, 4 J, 5 PRE, 7 Q (out), 8 !Q (out), 19 CLR
part B pins: 9 !Q (out), 12 Q (out), 13 PRE, 14 J, 15 K, 17 CLK, 18 CLR
part C pins: 10 GND (power), 20 VCC (power)

## 74*112N
designator IC?, comment Dual J-K negative edge triggered FLIP FLOP, preset and clear
footprint DIL16
part A pins: 1 CLK, 2 K, 3 J, 4 PRE, 5 Q (out), 6 !Q (out), 15 CLR
part B pins: 7 !Q (out), 9 Q (out), 10 PRE, 11 J, 12 K, 13 CLK, 14 CLR
part C pins: 8 GND (power), 16 VCC (power)

## 74*113D
designator IC?, comment Dual J-K negative edge triggered FLIP FLOP, preset
footprint SO14
part A pins: 1 CLK, 2 K, 3 J, 4 PRE, 5 Q (out), 6 !Q (out)
part B pins: 8 !Q (out), 9 Q (out), 10 PRE, 11 J, 12 K, 13 CLK
part C pins: 7 GND (power), 14 VCC (power)

## 74*113N
designator IC?, comment Dual J-K negative edge triggered FLIP FLOP, preset
footprint DIL14
part A pins: 1 CLK, 2 K, 3 J, 4 PRE, 5 Q (out), 6 !Q (out)
part B pins: 8 !Q (out), 9 Q (out), 10 PRE, 11 J, 12 K, 13 CLK
part C pins: 7 GND (power), 14 VCC (power)

## 74*114N
designator IC?, comment Dual J-K negative edge triggered FLIP FLOP, preset, common clear, clock
footprint DIL14
part A pins: 7 GND (power), 14 VCC (power)
part B pins: 1 CLR, 2 K1, 3 J1, 4 PR1, 5 Q1 (out), 6 !Q1 (out), 8 !Q2 (out), 9 Q2 (out), 10 PR2, 11 J2, 12 K2, 13 CLK

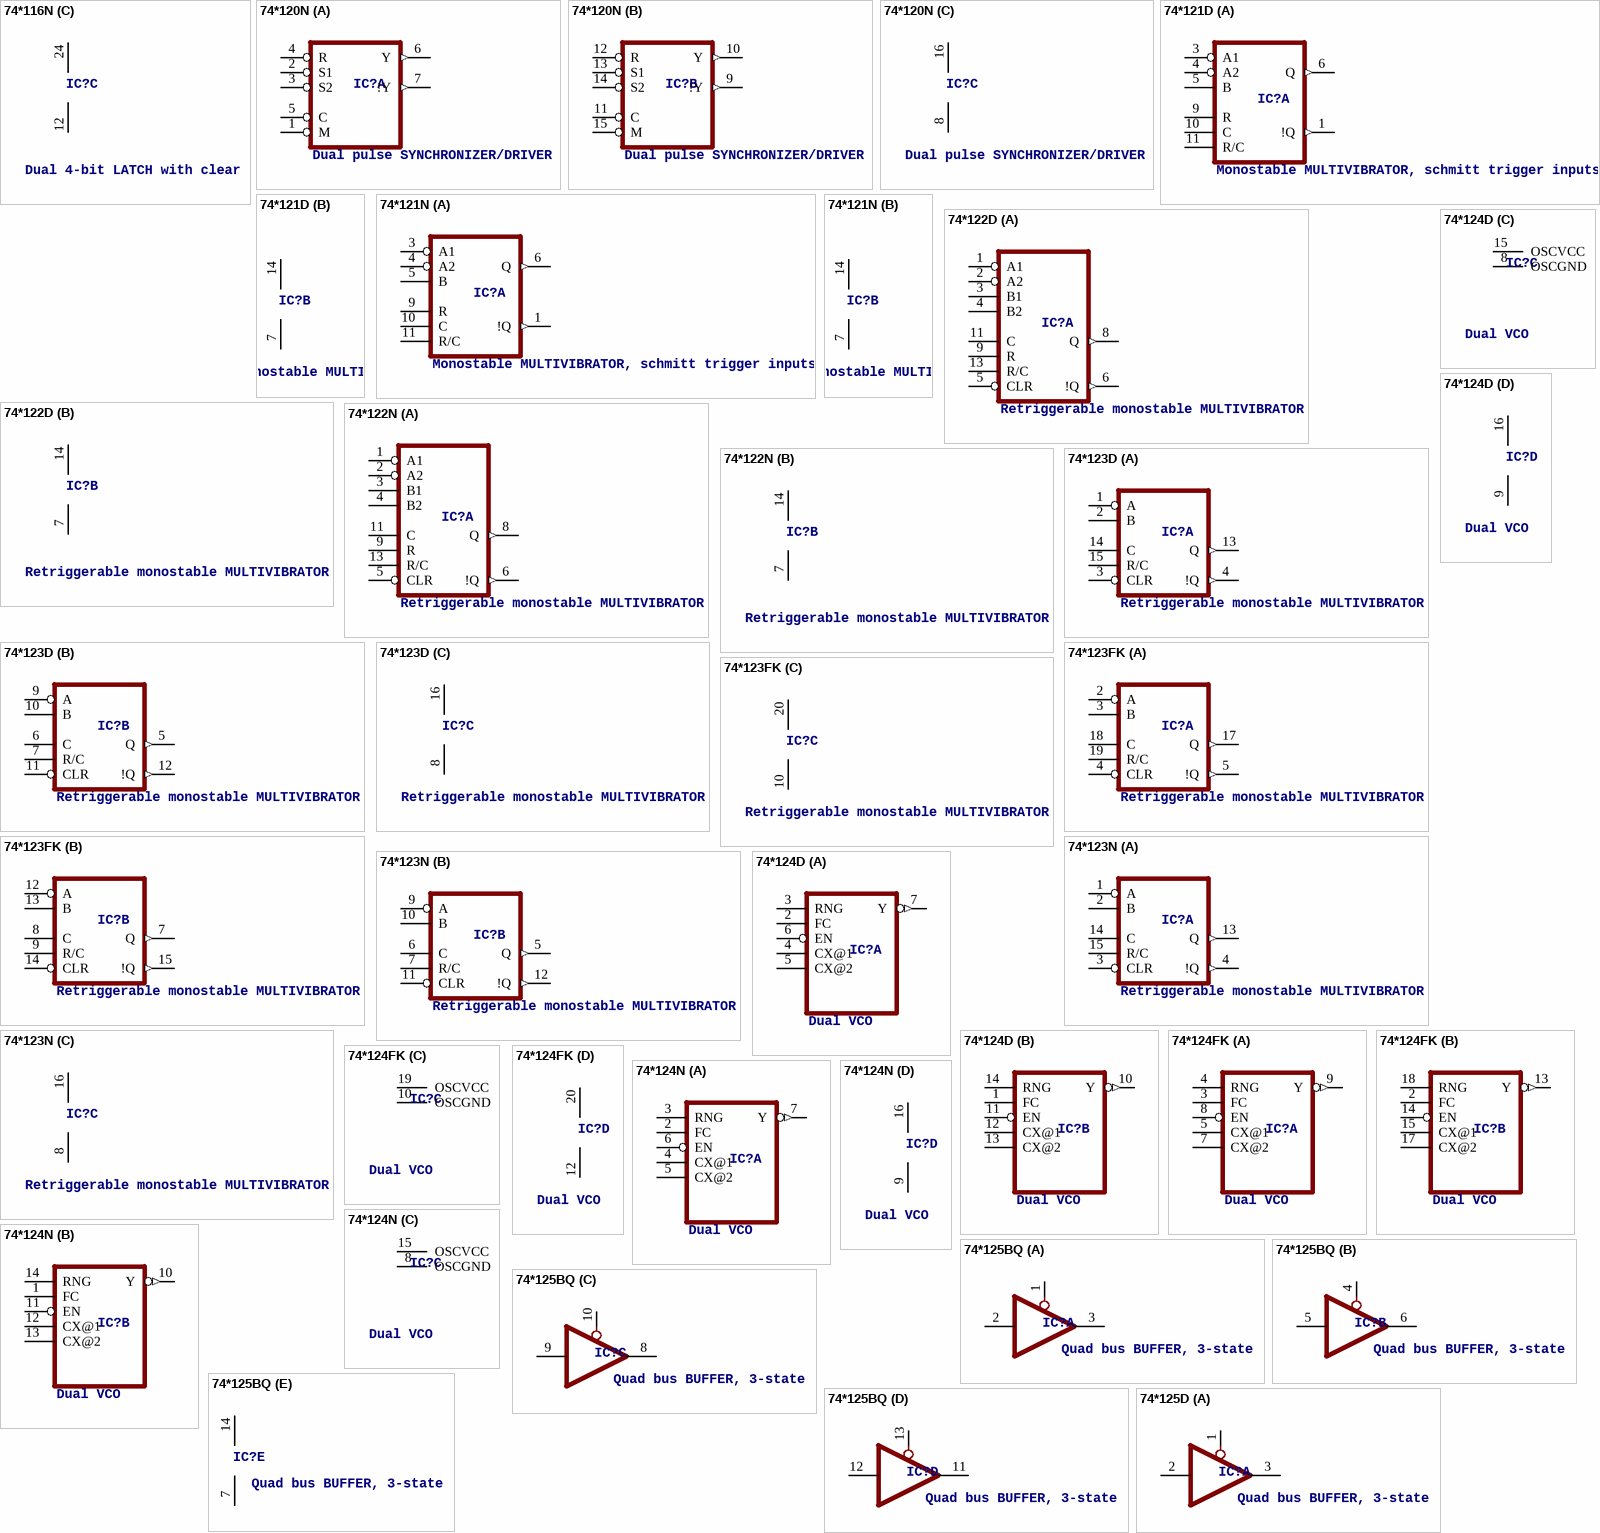
[diagram p17: symbols 74*116N to 74*125D]

## 74*116N
designator IC?, comment Dual 4-bit LATCH with clear
footprint DIL24-6
part A pins: 1 CLR, 2 G1, 3 G2, 4 D1, 5 Q1 (out), 6 D2, 7 Q2 (out), 8 D3, 9 Q3 (out), 10 D4, 11 Q4 (out)
part B pins: 13 CLR, 14 G1, 15 G2, 16 D1, 17 Q1 (out), 18 D2, 19 Q2 (out), 20 D3, 21 Q3 (out), 22 D4, 23 Q4 (out)
part C pins: 12 GND (power), 24 VCC (power)

## 74*120N
designator IC?, comment Dual pulse SYNCHRONIZER/DRIVER
footprint DIL16
part A pins: 1 M, 2 S1, 3 S2, 4 R, 5 C, 6 Y (out), 7 !Y (out)
part B pins: 9 !Y (out), 10 Y (out), 11 C, 12 R, 13 S1, 14 S2, 15 M
part C pins: 8 GND (power), 16 VCC (power)

## 74*121D
designator IC?, comment Monostable MULTIVIBRATOR, schmitt trigger inputs
footprint SO14
part A pins: 1 !Q (out), 3 A1, 4 A2, 5 B, 6 Q (out), 9 R, 10 C, 11 R/C
part B pins: 7 GND (power), 14 VCC (power)

## 74*121N
designator IC?, comment Monostable MULTIVIBRATOR, schmitt trigger inputs
footprint DIL14
part A pins: 1 !Q (out), 3 A1, 4 A2, 5 B, 6 Q (out), 9 R, 10 C, 11 R/C
part B pins: 7 GND (power), 14 VCC (power)

## 74*122D
designator IC?, comment Retriggerable monostable MULTIVIBRATOR
footprint SO14
part A pins: 1 A1, 2 A2, 3 B1, 4 B2, 5 CLR, 6 !Q (out), 8 Q (out), 9 R, 11 C, 13 R/C
part B pins: 7 GND (power), 14 VCC (power)

## 74*122N
designator IC?, comment Retriggerable monostable MULTIVIBRATOR
footprint DIL14
part A pins: 1 A1, 2 A2, 3 B1, 4 B2, 5 CLR, 6 !Q (out), 8 Q (out), 9 R, 11 C, 13 R/C
part B pins: 7 GND (power), 14 VCC (power)

## 74*123D
designator IC?, comment Retriggerable monostable MULTIVIBRATOR
footprint SO16
part A pins: 1 A, 2 B, 3 CLR, 4 !Q (out), 13 Q (out), 14 C, 15 R/C
part B pins: 5 Q (out), 6 C, 7 R/C, 9 A, 10 B, 11 CLR, 12 !Q (out)
part C pins: 8 GND (power), 16 VCC (power)

## 74*123FK
designator IC?, comment Retriggerable monostable MULTIVIBRATOR
footprint LCC20
part A pins: 2 A, 3 B, 4 CLR, 5 !Q (out), 17 Q (out), 18 C, 19 R/C
part B pins: 7 Q (out), 8 C, 9 R/C, 12 A, 13 B, 14 CLR, 15 !Q (out)
part C pins: 10 GND (power), 20 VCC (power)

## 74*123N
designator IC?, comment Retriggerable monostable MULTIVIBRATOR
footprint DIL16
part A pins: 1 A, 2 B, 3 CLR, 4 !Q (out), 13 Q (out), 14 C, 15 R/C
part B pins: 5 Q (out), 6 C, 7 R/C, 9 A, 10 B, 11 CLR, 12 !Q (out)
part C pins: 8 GND (power), 16 VCC (power)

## 74*124D
designator IC?, comment Dual VCO
footprint SO16
part A pins: 2 FC, 3 RNG, 4 CX@1, 5 CX@2, 6 EN, 7 Y (out)
part B pins: 1 FC, 10 Y (out), 11 EN, 12 CX@1, 13 CX@2, 14 RNG
part C pins: 8 OSCGND (power), 15 OSCVCC (power)
part D pins: 9 GND (power), 16 VCC (power)

## 74*124FK
designator IC?, comment Dual VCO
footprint LCC20
part A pins: 3 FC, 4 RNG, 5 CX@1, 7 CX@2, 8 EN, 9 Y (out)
part B pins: 2 FC, 13 Y (out), 14 EN, 15 CX@1, 17 CX@2, 18 RNG
part C pins: 10 OSCGND (power), 19 OSCVCC (power)
part D pins: 12 GND (power), 20 VCC (power)

## 74*124N
designator IC?, comment Dual VCO
footprint DIL16
part A pins: 2 FC, 3 RNG, 4 CX@1, 5 CX@2, 6 EN, 7 Y (out)
part B pins: 1 FC, 10 Y (out), 11 EN, 12 CX@1, 13 CX@2, 14 RNG
part C pins: 8 OSCGND (power), 15 OSCVCC (power)
part D pins: 9 GND (power), 16 VCC (power)

## 74*125BQ
designator IC?, comment Quad bus BUFFER, 3-state
footprint DHVQFN14
part A pins: 1 OE, 2 I, 3 O (hiz)
part B pins: 4 OE, 5 I, 6 O (hiz)
part C pins: 8 O (hiz), 9 I, 10 OE
part D pins: 11 O (hiz), 12 I, 13 OE
part E pins: 7 GND (power), 14 VCC (power)

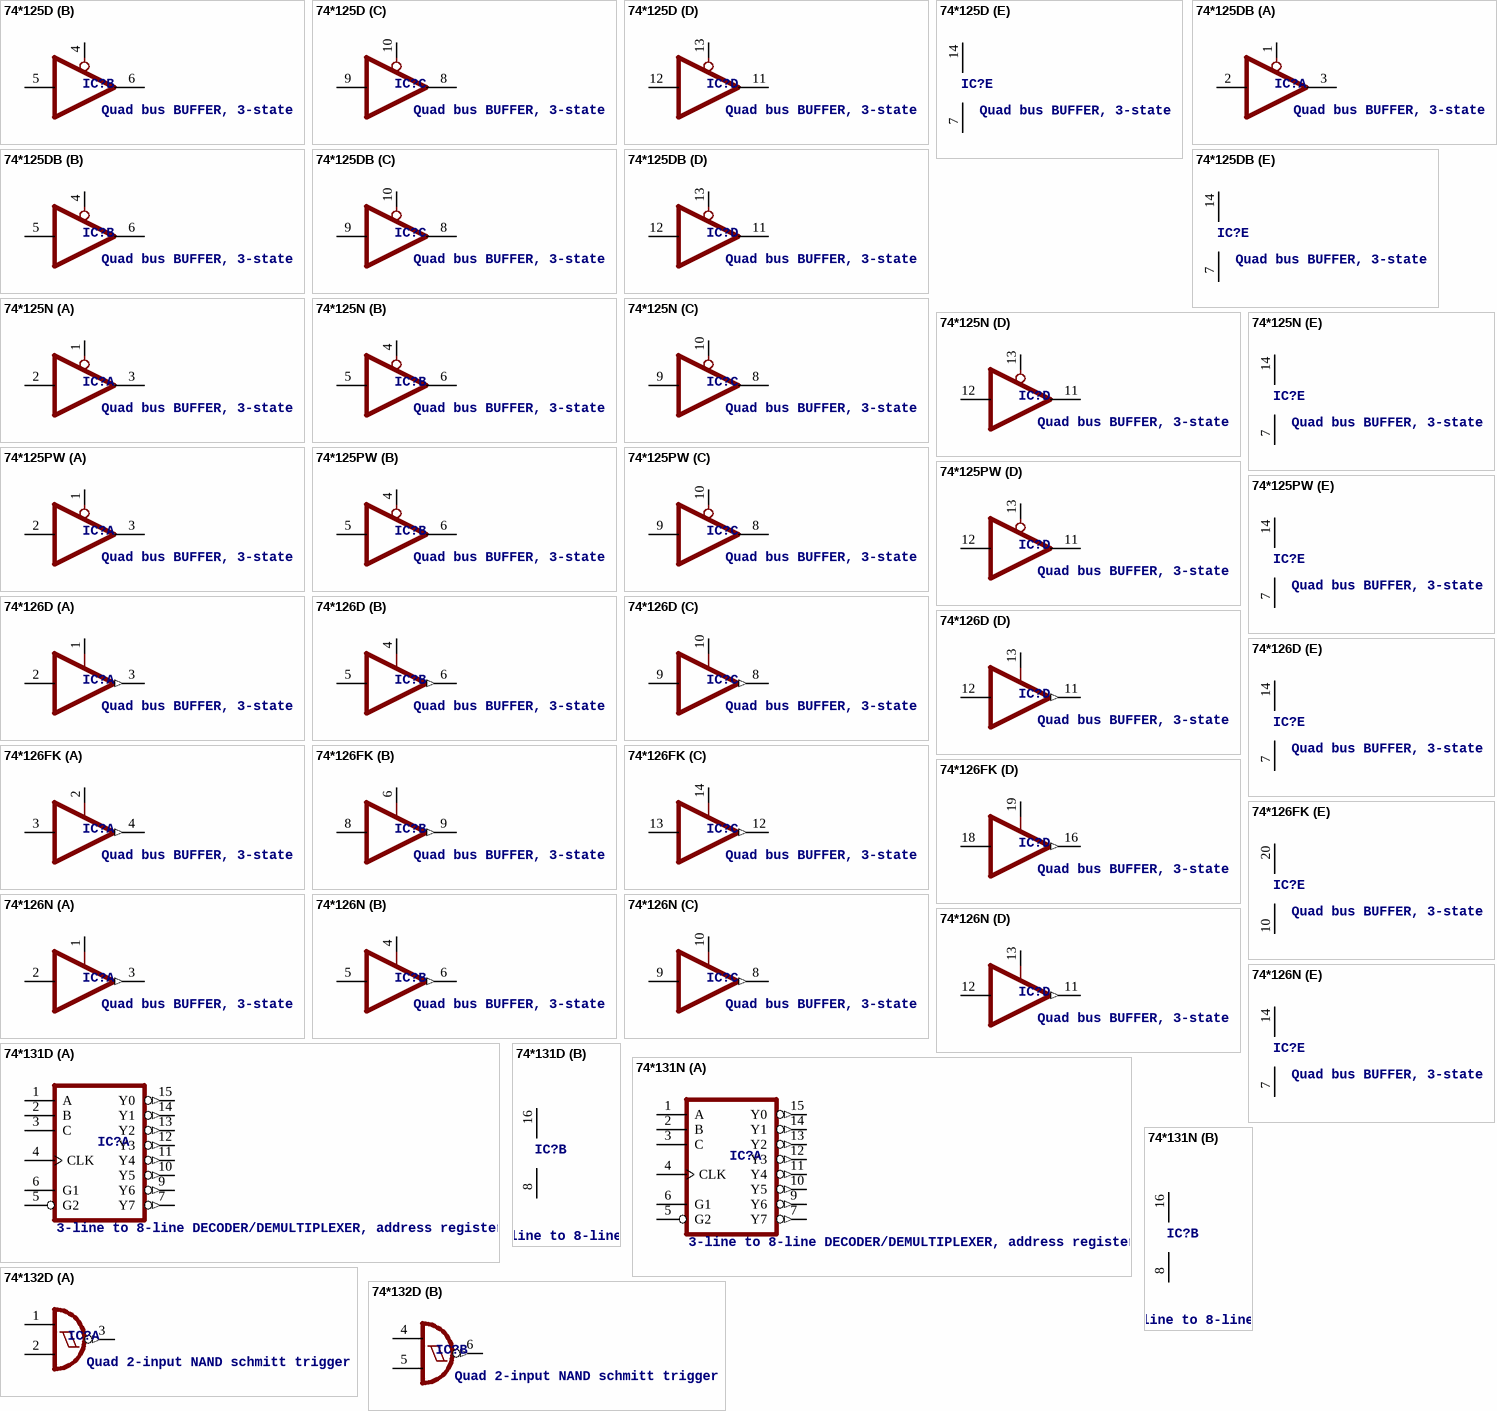
[diagram p18: symbols 74*125D to 74*132D]

## 74*125D
designator IC?, comment Quad bus BUFFER, 3-state
footprint SO14
part A pins: 1 OE, 2 I, 3 O (hiz)
part B pins: 4 OE, 5 I, 6 O (hiz)
part C pins: 8 O (hiz), 9 I, 10 OE
part D pins: 11 O (hiz), 12 I, 13 OE
part E pins: 7 GND (power), 14 VCC (power)

## 74*125DB
designator IC?, comment Quad bus BUFFER, 3-state
footprint SSOP14
part A pins: 1 OE, 2 I, 3 O (hiz)
part B pins: 4 OE, 5 I, 6 O (hiz)
part C pins: 8 O (hiz), 9 I, 10 OE
part D pins: 11 O (hiz), 12 I, 13 OE
part E pins: 7 GND (power), 14 VCC (power)

## 74*125N
designator IC?, comment Quad bus BUFFER, 3-state
footprint DIL14
part A pins: 1 OE, 2 I, 3 O (hiz)
part B pins: 4 OE, 5 I, 6 O (hiz)
part C pins: 8 O (hiz), 9 I, 10 OE
part D pins: 11 O (hiz), 12 I, 13 OE
part E pins: 7 GND (power), 14 VCC (power)

## 74*125PW
designator IC?, comment Quad bus BUFFER, 3-state
footprint TSSOP14
part A pins: 1 OE, 2 I, 3 O (hiz)
part B pins: 4 OE, 5 I, 6 O (hiz)
part C pins: 8 O (hiz), 9 I, 10 OE
part D pins: 11 O (hiz), 12 I, 13 OE
part E pins: 7 GND (power), 14 VCC (power)

## 74*126D
designator IC?, comment Quad bus BUFFER, 3-state
footprint SO14
part A pins: 1 OE, 2 I, 3 O (out)
part B pins: 4 OE, 5 I, 6 O (out)
part C pins: 8 O (out), 9 I, 10 OE
part D pins: 11 O (out), 12 I, 13 OE
part E pins: 7 GND (power), 14 VCC (power)

## 74*126FK
designator IC?, comment Quad bus BUFFER, 3-state
footprint LCC20
part A pins: 2 OE, 3 I, 4 O (out)
part B pins: 6 OE, 8 I, 9 O (out)
part C pins: 12 O (out), 13 I, 14 OE
part D pins: 16 O (out), 18 I, 19 OE
part E pins: 10 GND (power), 20 VCC (power)

## 74*126N
designator IC?, comment Quad bus BUFFER, 3-state
footprint DIL14
part A pins: 1 OE, 2 I, 3 O (out)
part B pins: 4 OE, 5 I, 6 O (out)
part C pins: 8 O (out), 9 I, 10 OE
part D pins: 11 O (out), 12 I, 13 OE
part E pins: 7 GND (power), 14 VCC (power)

## 74*131D
designator IC?, comment 3-line to 8-line DECODER/DEMULTIPLEXER, address register
footprint SO16
part A pins: 1 A, 2 B, 3 C, 4 CLK, 5 G2, 6 G1, 7 Y7 (out), 9 Y6 (out), 10 Y5 (out), 11 Y4 (out), 12 Y3 (out), 13 Y2 (out), 14 Y1 (out), 15 Y0 (out)
part B pins: 8 GND (power), 16 VCC (power)

## 74*131N
designator IC?, comment 3-line to 8-line DECODER/DEMULTIPLEXER, address register
footprint DIL16
part A pins: 1 A, 2 B, 3 C, 4 CLK, 5 G2, 6 G1, 7 Y7 (out), 9 Y6 (out), 10 Y5 (out), 11 Y4 (out), 12 Y3 (out), 13 Y2 (out), 14 Y1 (out), 15 Y0 (out)
part B pins: 8 GND (power), 16 VCC (power)

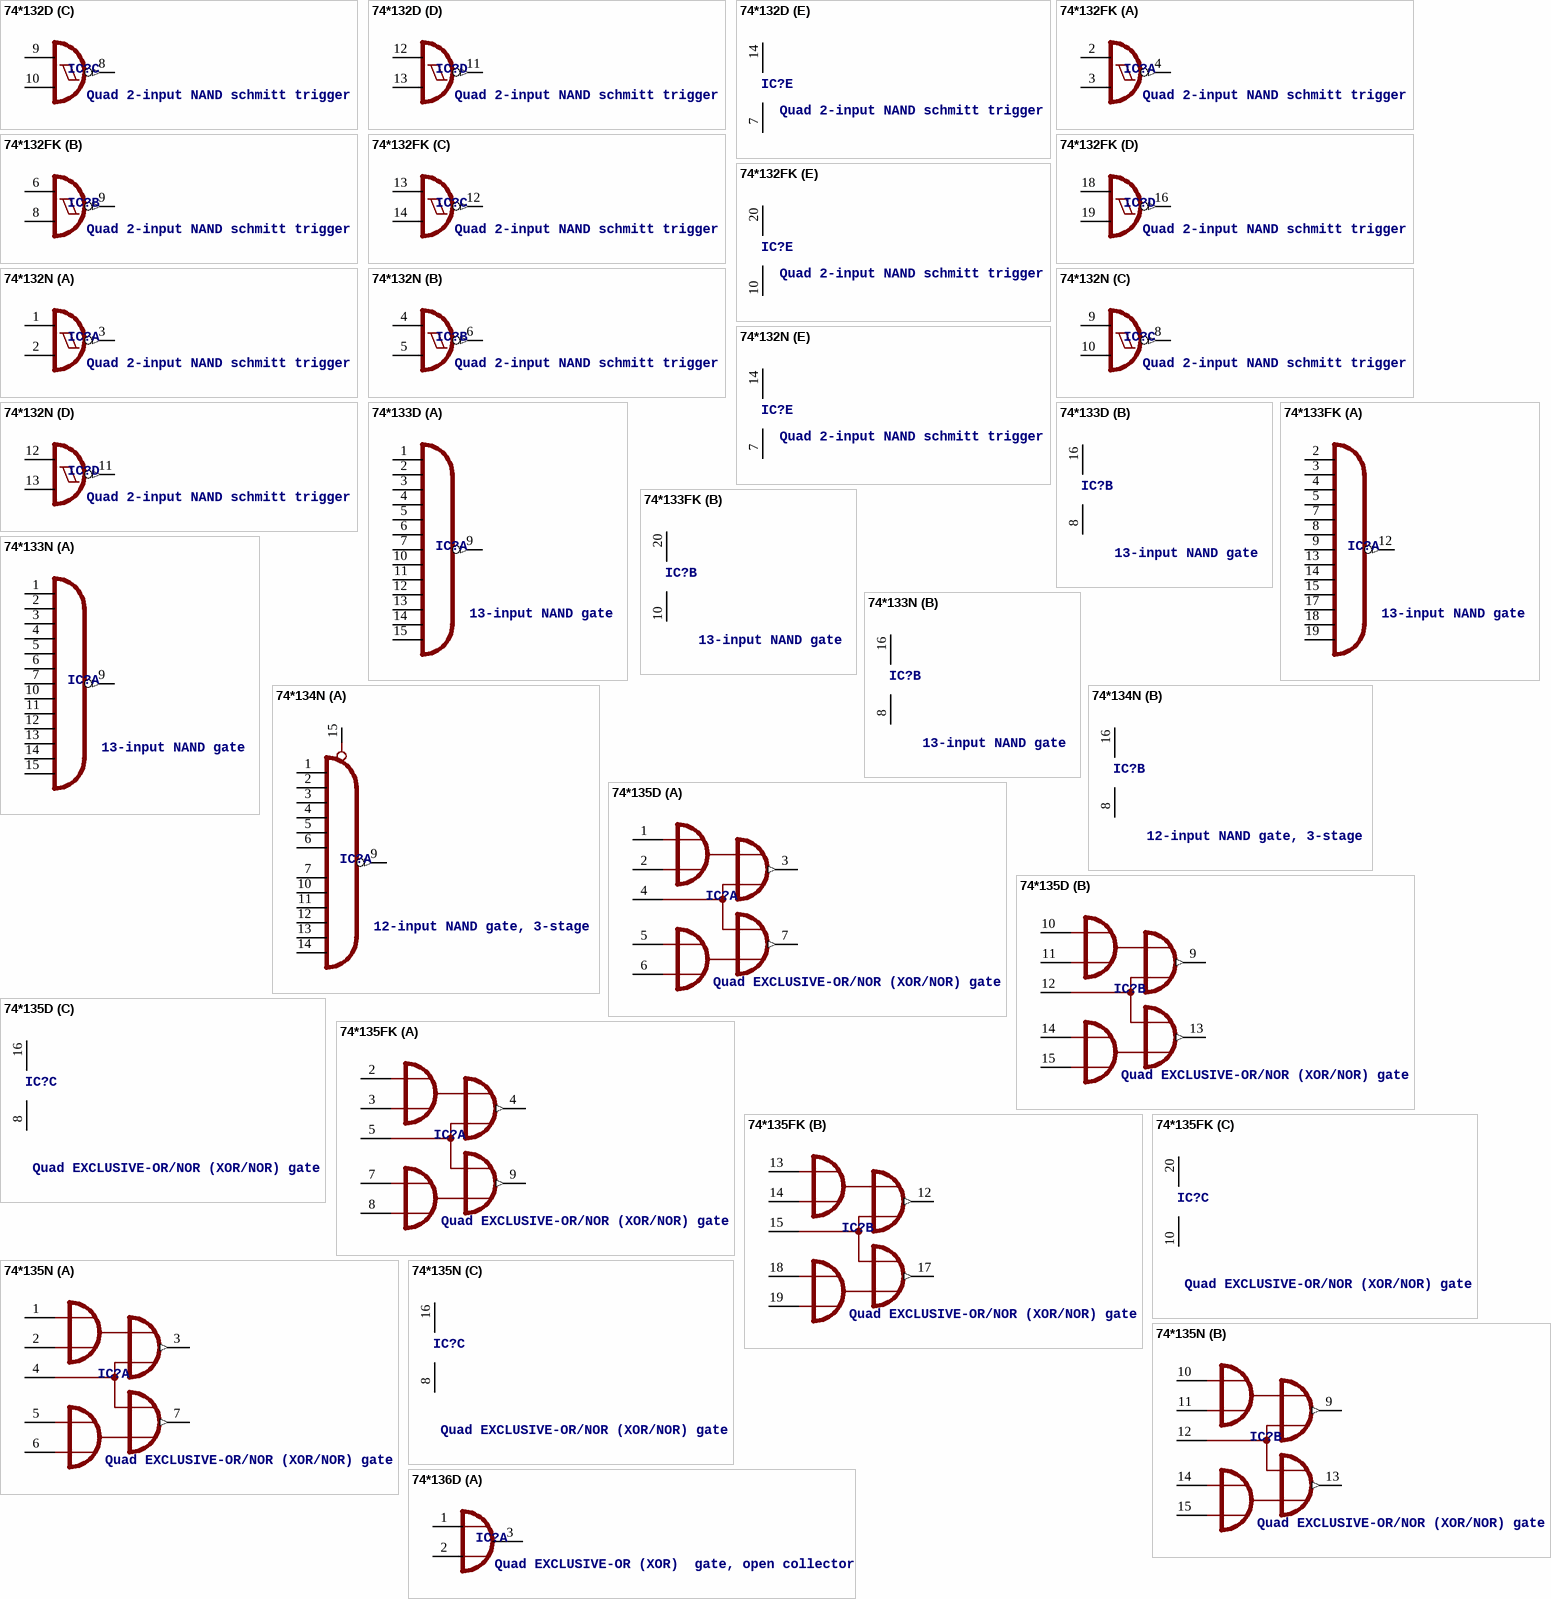
[diagram p19: symbols 74*132D to 74*136D]

## 74*132D
designator IC?, comment Quad 2-input NAND schmitt trigger
footprint SO14
part A pins: 1 I0, 2 I1, 3 O (out)
part B pins: 4 I0, 5 I1, 6 O (out)
part C pins: 8 O (out), 9 I0, 10 I1
part D pins: 11 O (out), 12 I0, 13 I1
part E pins: 7 GND (power), 14 VCC (power)

## 74*132FK
designator IC?, comment Quad 2-input NAND schmitt trigger
footprint LCC20
part A pins: 2 I0, 3 I1, 4 O (out)
part B pins: 6 I0, 8 I1, 9 O (out)
part C pins: 12 O (out), 13 I0, 14 I1
part D pins: 16 O (out), 18 I0, 19 I1
part E pins: 10 GND (power), 20 VCC (power)

## 74*132N
designator IC?, comment Quad 2-input NAND schmitt trigger
footprint DIL14
part A pins: 1 I0, 2 I1, 3 O (out)
part B pins: 4 I0, 5 I1, 6 O (out)
part C pins: 8 O (out), 9 I0, 10 I1
part D pins: 11 O (out), 12 I0, 13 I1
part E pins: 7 GND (power), 14 VCC (power)

## 74*133D
designator IC?, comment 13-input NAND gate
footprint SO16
part A pins: 1 I0, 2 I1, 3 I2, 4 I3, 5 I4, 6 I5, 7 I6, 9 O (out), 10 I7, 11 I8, 12 I9, 13 I10, 14 I11, 15 I12
part B pins: 8 GND (power), 16 VCC (power)

## 74*133FK
designator IC?, comment 13-input NAND gate
footprint LCC20
part A pins: 2 I0, 3 I1, 4 I2, 5 I3, 7 I4, 8 I5, 9 I6, 12 O (out), 13 I7, 14 I8, 15 I9, 17 I10, 18 I11, 19 I12
part B pins: 10 GND (power), 20 VCC (power)

## 74*133N
designator IC?, comment 13-input NAND gate
footprint DIL16
part A pins: 1 I0, 2 I1, 3 I2, 4 I3, 5 I4, 6 I5, 7 I6, 9 O (out), 10 I7, 11 I8, 12 I9, 13 I10, 14 I11, 15 I12
part B pins: 8 GND (power), 16 VCC (power)

## 74*134N
designator IC?, comment 12-input NAND gate, 3-stage
footprint DIL16
part A pins: 1 I0, 2 I1, 3 I2, 4 I3, 5 I4, 6 I5, 7 I6, 9 O (out), 10 I7, 11 I8, 12 I9, 13 I10, 14 I11, 15 OE
part B pins: 8 GND (power), 16 VCC (power)

## 74*135D
designator IC?, comment Quad EXCLUSIVE-OR/NOR (XOR/NOR) gate
footprint SO16
part A pins: 1 1A, 2 1B, 3 1Y (out), 4 C, 5 2A, 6 2B, 7 2Y (out)
part B pins: 9 1Y (out), 10 1A, 11 1B, 12 C, 13 2Y (out), 14 2A, 15 2B
part C pins: 8 GND (power), 16 VCC (power)